# Altium schematic symbol library PowerProducts.SCHLIB: 595 symbols (part 3 of 6)
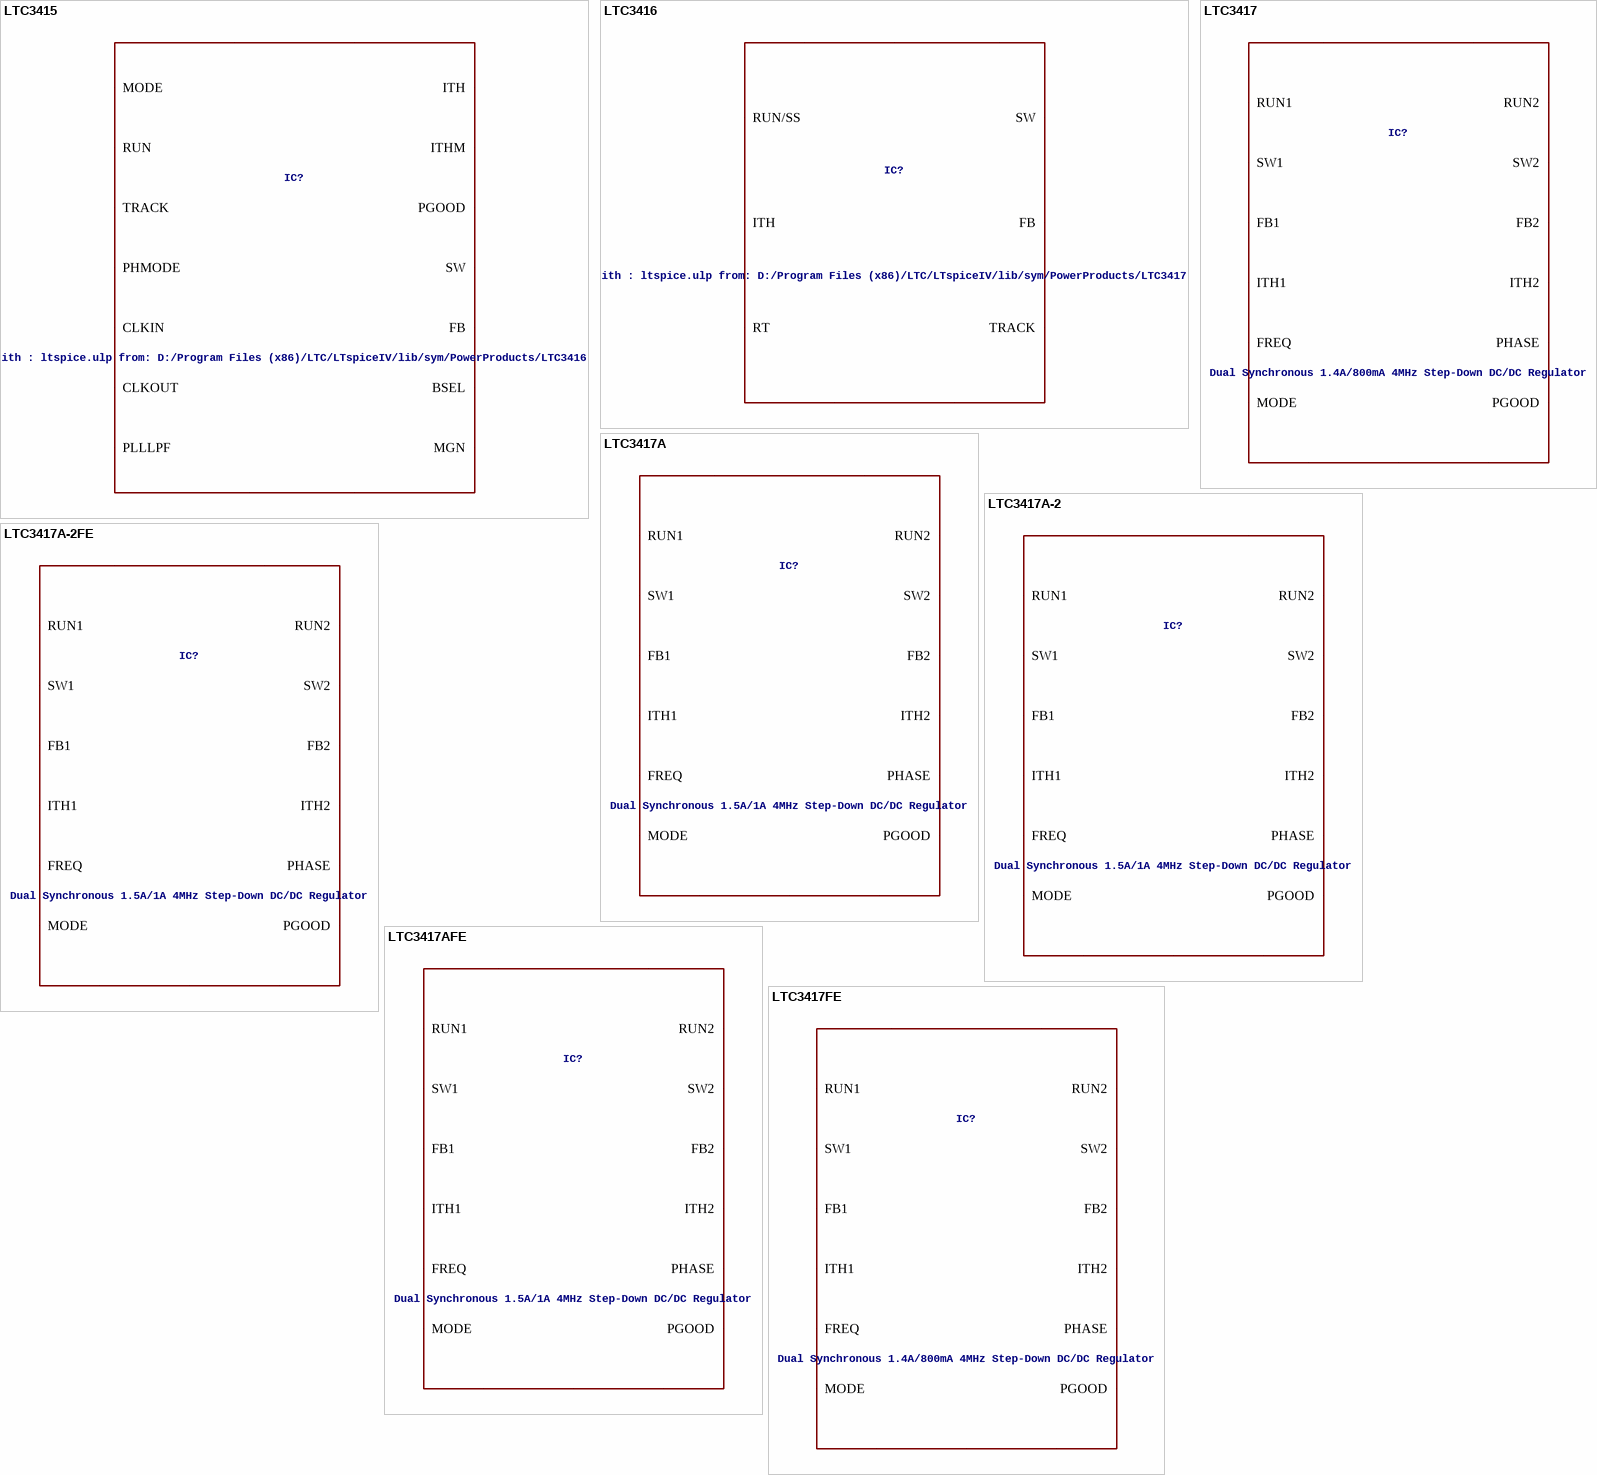
[diagram p114: symbols LTC3415 to LTC3417FE]

## LTC3417AFE
designator IC?, comment Dual Synchronous 1.5A/1A 4MHz Step-Down DC/DC Regulator
VALUE2: LTC3417A; SPICEMODEL: LTC3417A.sub; SPICEPREFIX: X
footprint TSSOP20CA(FE)
pins: 1 10 11 20 21 PGND2, 2 RUN1, 3 VIN1, 4 ITH1, 5 FB1, 6 FB2, 7 ITH2, 8 RUN2, 9 VIN2, 12 MODE, 13 SW2, 14 PGOOD, 15 FREQ, 16 GNDA, 17 PHASE, 18 SW1, 19 PGND1

## LTC3417FE
designator IC?, comment Dual Synchronous 1.4A/800mA 4MHz Step-Down DC/DC Regulator
VALUE2: LTC3417; SPICEMODEL: LTC3417.sub; SPICEPREFIX: X
footprint TSSOP20CA(FE)
pins: 1 10 11 20 21 PGND2, 2 RUN1, 3 VIN1, 4 ITH1, 5 FB1, 6 FB2, 7 ITH2, 8 RUN2, 9 VIN2, 12 MODE, 13 SW2, 14 PGOOD, 15 FREQ, 16 GNDA, 17 PHASE, 18 SW1, 19 PGND1

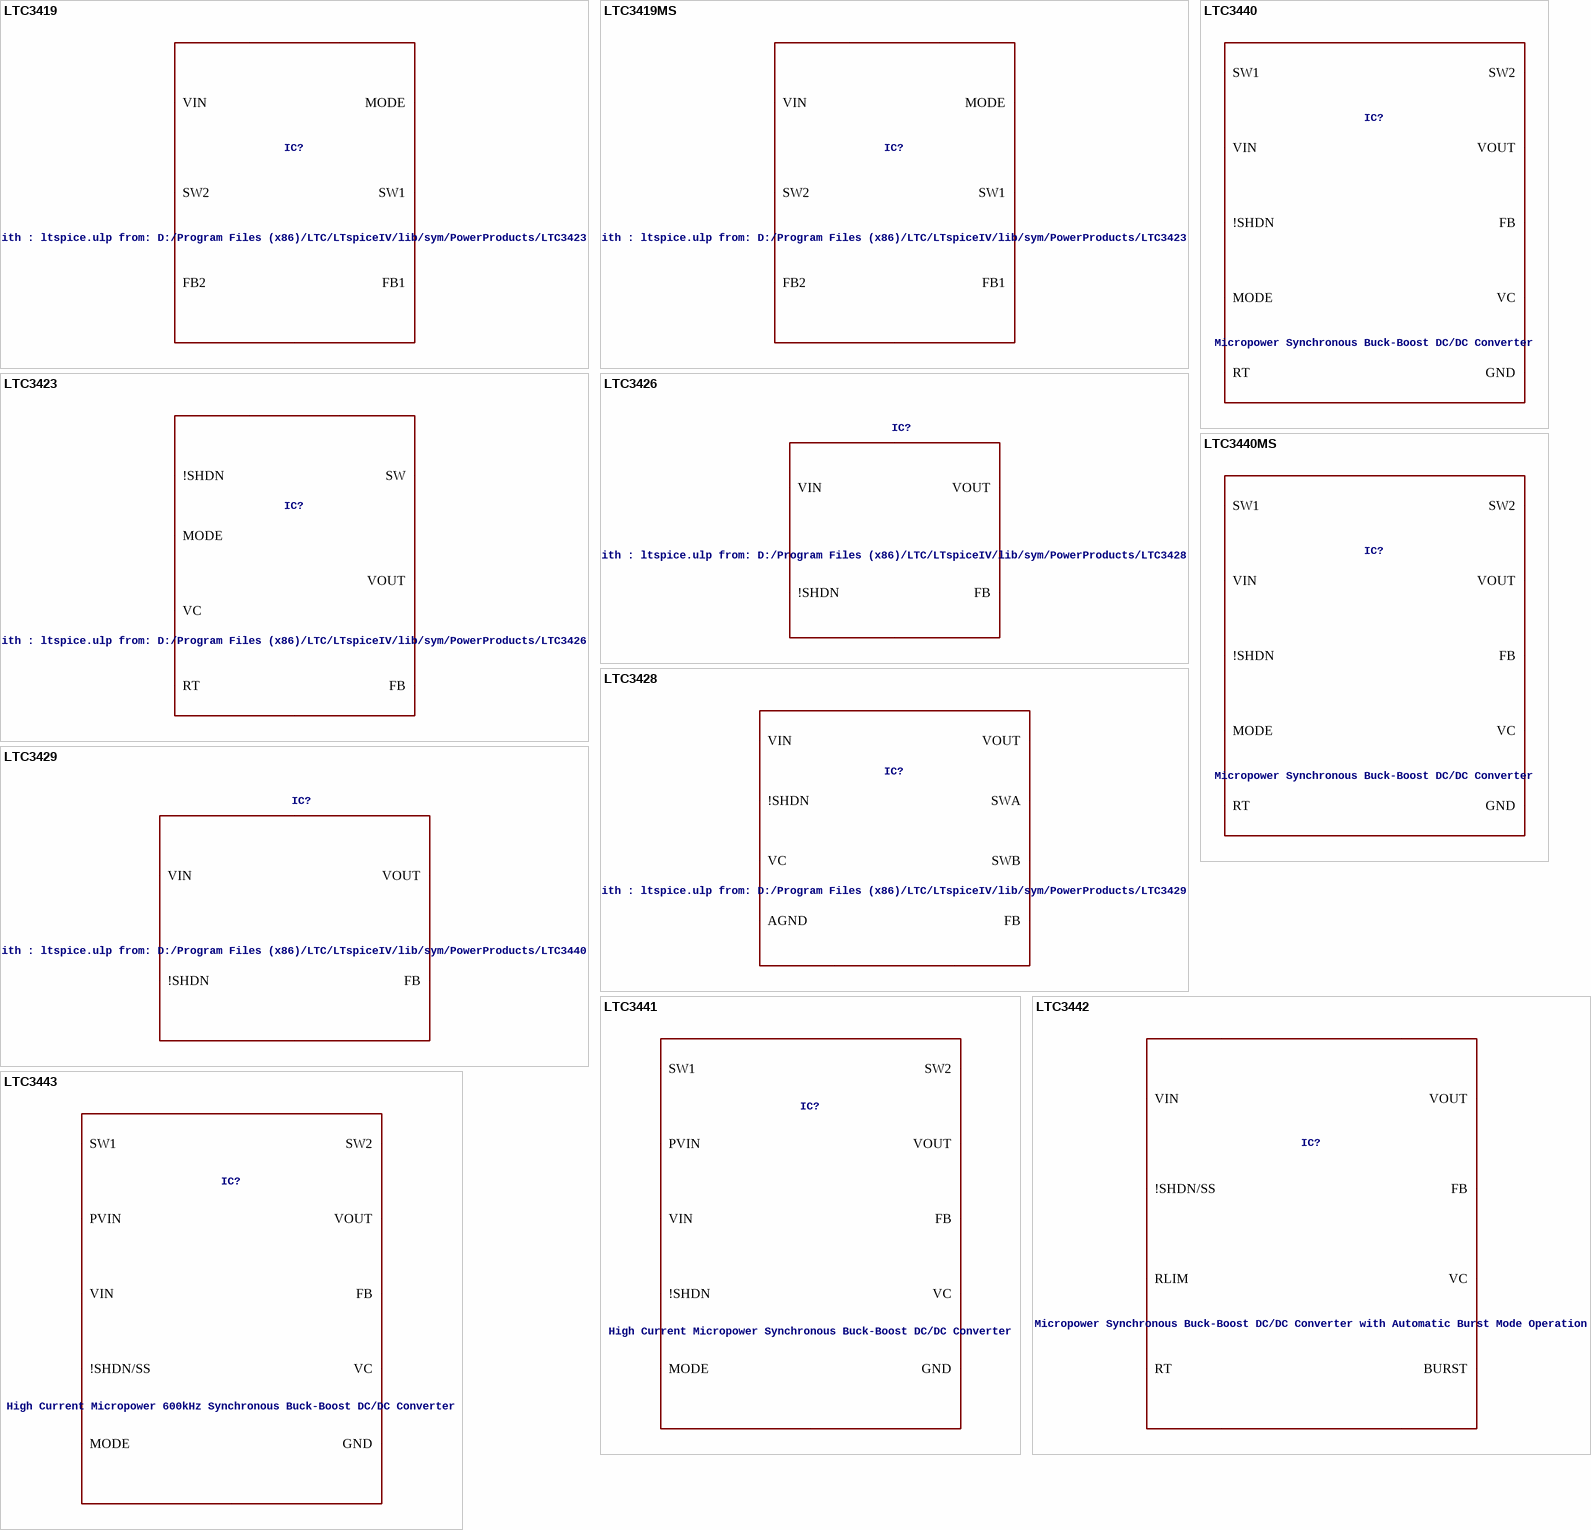
[diagram p43: symbols LTC3419 to LTC3443]

## LTC3419
designator IC?, comment LT-Spice library generated with : ltspice.ulp from: D:/Program Files (x86)/LTC/LTspiceIV/lib/sym/PowerProducts/LTC3423*.asy at 07.10.2012 18:07:52
VALUE2: LTC3419; SPICEMODEL: LTC3419.sub; SPICEPREFIX: X
footprint DFN8(DD)
pins: 1 FB1, 2 RUN1, 3 MODE, 4 SW1, 5 VIN, 6 SW2, 7 RUN2, 8 FB2, 9 GND

## LTC3419MS
designator IC?, comment LT-Spice library generated with : ltspice.ulp from: D:/Program Files (x86)/LTC/LTspiceIV/lib/sym/PowerProducts/LTC3423*.asy at 07.10.2012 18:07:52
VALUE2: LTC3419; SPICEMODEL: LTC3419.sub; SPICEPREFIX: X
footprint MSOP10(MS)
pins: 1 FB1, 2 RUN1, 3 MODE, 4 SW1, 5 6 GND, 7 VIN, 8 SW2, 9 RUN2, 10 FB2

## LTC3423
designator IC?, comment LT-Spice library generated with : ltspice.ulp from: D:/Program Files (x86)/LTC/LTspiceIV/lib/sym/PowerProducts/LTC3426*.asy at 07.10.2012 18:08:02
VALUE2: LTC3423; SPICEMODEL: LTC3423.sub; SPICEPREFIX: X
footprint MSOP10(MS)
pins: 1 RT, 2 MODE, 3 VIN, 4 SW, 5 GND, 6 VDD, 7 VOUT, 8 FB, 9 VC, 10 !SHDN

## LTC3426
designator IC?, comment LT-Spice library generated with : ltspice.ulp from: D:/Program Files (x86)/LTC/LTspiceIV/lib/sym/PowerProducts/LTC3428*.asy at 07.10.2012 18:08:11
VALUE2: LTC3426; SPICEMODEL: LTC3426.sub; SPICEPREFIX: X
footprint SOT6(S6)
pins: 1 SW, 2 GND, 3 FB, 4 !SHDN, 5 VOUT, 6 VIN

## LTC3428
designator IC?, comment LT-Spice library generated with : ltspice.ulp from: D:/Program Files (x86)/LTC/LTspiceIV/lib/sym/PowerProducts/LTC3429*.asy at 07.10.2012 18:08:16
VALUE2: LTC3428; SPICEMODEL: LTC3428.sub; SPICEPREFIX: X
footprint DFN10(DD)
pins: 1 11 PGNDA, 2 SWA, 3 VOUT, 4 !SHDN, 5 VC, 6 FB, 7 AGND, 8 VIN, 9 SWB, 10 PGNDB

## LTC3429
designator IC?, comment LT-Spice library generated with : ltspice.ulp from: D:/Program Files (x86)/LTC/LTspiceIV/lib/sym/PowerProducts/LTC3440*.asy at 07.10.2012 18:08:41
VALUE2: LTC3429; SPICEMODEL: LTC3429.sub; SPICEPREFIX: X
footprint SOT6(S6)
pins: 1 SW, 2 GND, 3 FB, 4 !SHDN, 5 VOUT, 6 VIN

## LTC3440
designator IC?, comment Micropower Synchronous Buck-Boost DC/DC Converter
VALUE2: LTC3440; SPICEMODEL: LTC3440.sub; SPICEPREFIX: X
footprint DFN10(DD)
pins: 1 RT, 2 MODE, 3 SW1, 4 SW2, 5 11 GND, 6 VOUT, 7 VIN, 8 !SHDN, 9 FB, 10 VC

## LTC3440MS
designator IC?, comment Micropower Synchronous Buck-Boost DC/DC Converter
VALUE2: LTC3440; SPICEMODEL: LTC3440.sub; SPICEPREFIX: X
footprint MSOP10(MS)
pins: 1 RT, 2 MODE, 3 SW1, 4 SW2, 5 GND, 6 VOUT, 7 VIN, 8 !SHDN, 9 FB, 10 VC

## LTC3441
designator IC?, comment High Current Micropower Synchronous Buck-Boost DC/DC Converter
VALUE2: LTC3441; SPICEMODEL: LTC3441.sub; SPICEPREFIX: X
footprint DFN12(DE)
pins: 1 !SHDN, 2 GND, 3 6 13 PGND, 4 SW1, 5 SW2, 7 MODE, 8 VOUT, 9 PVIN, 10 VIN, 11 VC, 12 FB

## LTC3442
designator IC?, comment Micropower Synchronous Buck-Boost DC/DC Converter with Automatic Burst Mode Operation
VALUE2: LTC3442; SPICEMODEL: LTC3442.sub; SPICEPREFIX: X
footprint DFN12(DE)
pins: 1 !SHDN/SS, 2 RT, 3 SGND, 4 SW1, 5 13 PGND, 6 SW2, 7 BURST, 8 VOUT, 9 VIN, 10 RLIM, 11 VC, 12 FB

## LTC3443
designator IC?, comment High Current Micropower 600kHz Synchronous Buck-Boost DC/DC Converter
VALUE2: LTC3443; SPICEMODEL: LTC3443.sub; SPICEPREFIX: X
footprint DFN12(DE)
pins: 1 !SHDN/SS, 2 GND, 3 6 13 PGND, 4 SW1, 5 SW2, 7 MODE, 8 VOUT, 9 PVIN, 10 VIN, 11 VC, 12 FB

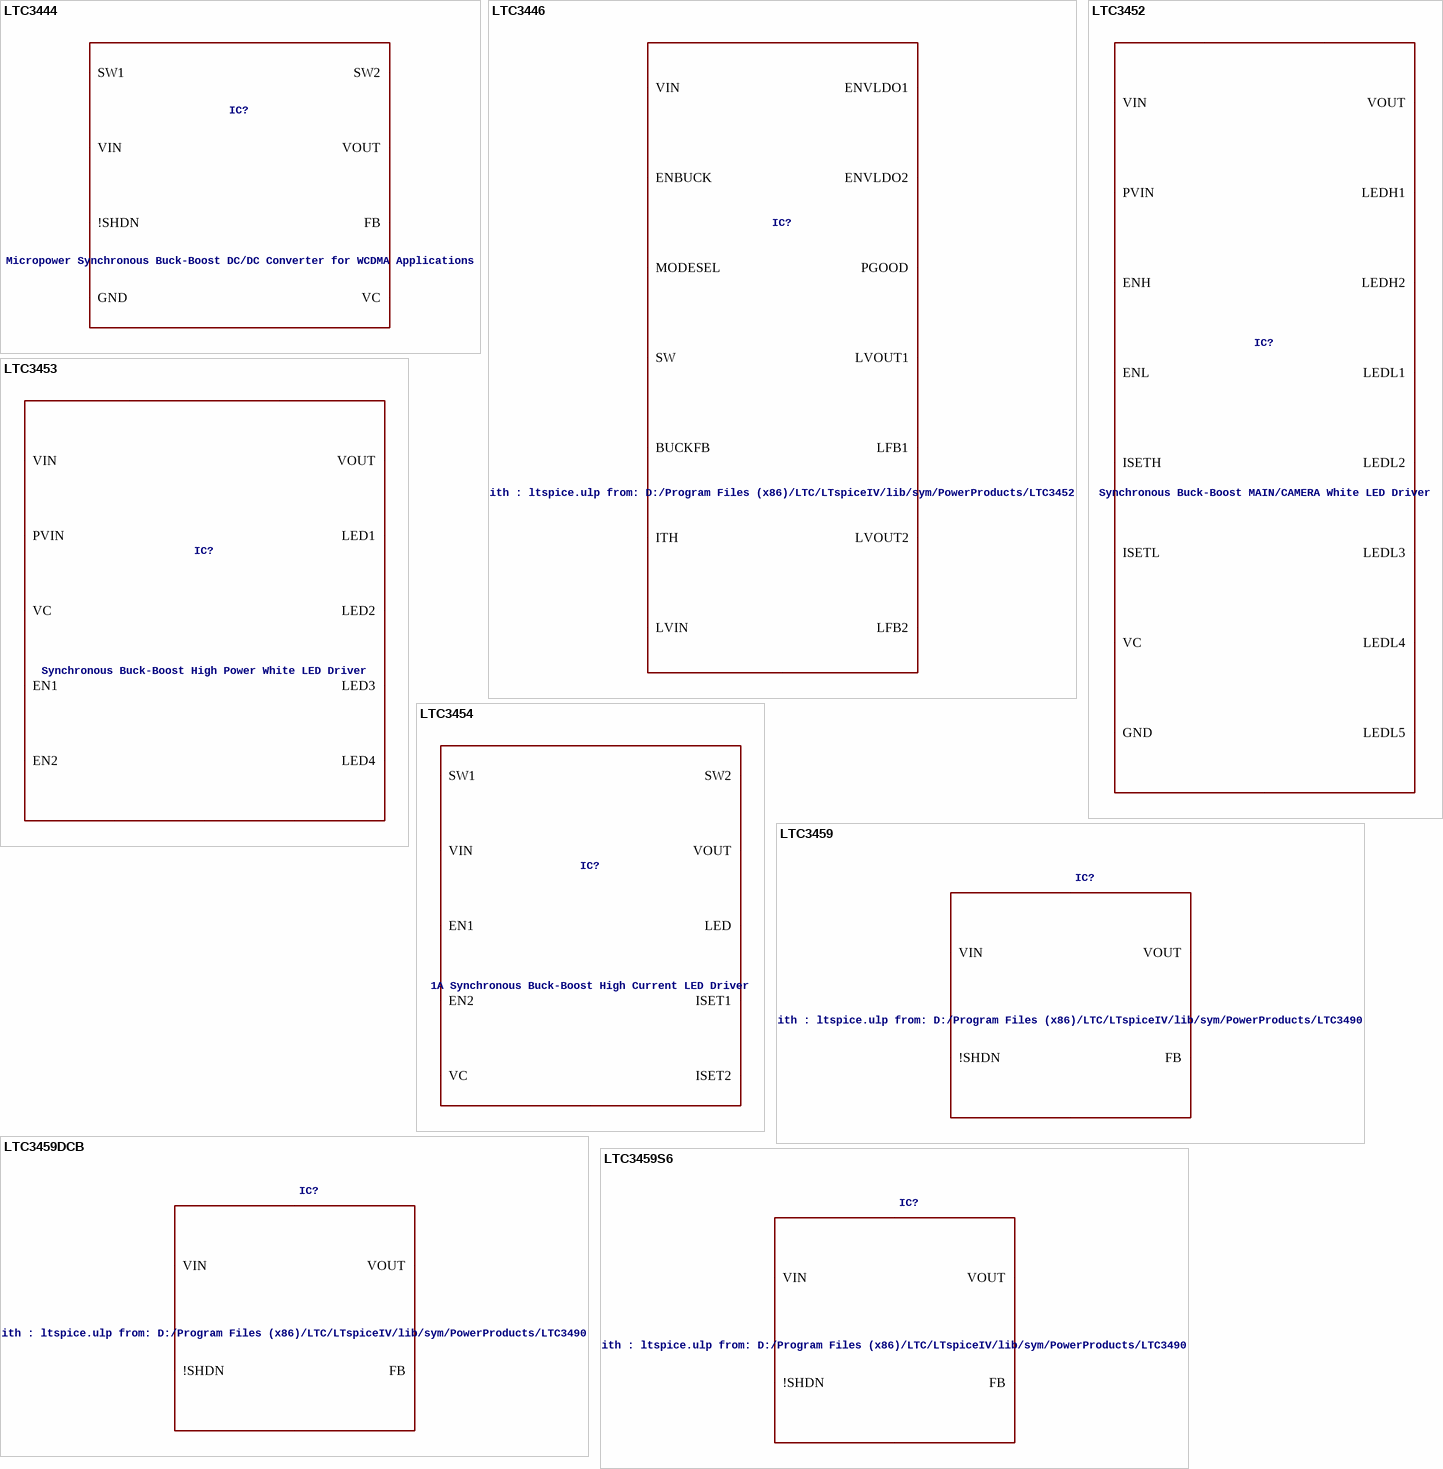
[diagram p44: symbols LTC3444 to LTC3459S6]

## LTC3444
designator IC?, comment Micropower Synchronous Buck-Boost DC/DC Converter for WCDMA Applications
VALUE2: LTC3444; SPICEMODEL: LTC3444.sub; SPICEPREFIX: X
footprint DFN8(DD)
pins: 1 !SHDN, 2 SW1, 3 9 GND, 4 SW2, 5 VOUT, 6 VIN, 7 VC, 8 FB

## LTC3446
designator IC?, comment LT-Spice library generated with : ltspice.ulp from: D:/Program Files (x86)/LTC/LTspiceIV/lib/sym/PowerProducts/LTC3452*.asy at 07.10.2012 18:09:42
VALUE2: LTC3446; SPICEMODEL: LTC3446.sub; SPICEPREFIX: X
footprint DFN14(DE)
pins: 1 MODESEL, 2 VIN, 3 ITH, 4 PGOOD, 5 LVOUT1, 6 LVIN, 7 LVOUT2, 8 ENVLDO2, 9 LFB2, 10 LFB1, 11 ENVLDO1, 12 BUCKFB, 13 ENBUCK, 14 SW, 15 GND

## LTC3452
designator IC?, comment Synchronous Buck-Boost MAIN/CAMERA White LED Driver
VALUE2: LTC3452; SPICEMODEL: LTC3452.sub; SPICEPREFIX: X
footprint QFN20(UF)
pins: 1 VIN, 2 ENL, 3 ISETL, 4 LEDL1, 5 LEDL2, 6 LEDL3, 7 LEDL4, 8 LEDL5, 9 11 21 GND, 10 LEDH1, 12 LEDH2, 13 ISETH, 14 ENH, 15 VC, 16 VOUT, 17 SW2, 18 PGND, 19 SW1, 20 PVIN

## LTC3453
designator IC?, comment Synchronous Buck-Boost High Power White LED Driver
VALUE2: LTC3453; SPICEMODEL: LTC3453.sub; SPICEPREFIX: X
footprint QFN16(UF)
pins: 1 VIN, 2 EN1, 3 ISET1, 4 LED1, 5 8 17 GND, 6 LED2, 7 LED3, 9 LED4, 10 ISET2, 11 EN2, 12 VC, 13 VOUT, 14 SW2, 15 SW1, 16 PVIN

## LTC3454
designator IC?, comment 1A Synchronous Buck-Boost High Current LED Driver
VALUE2: LTC3454; SPICEMODEL: LTC3454.sub; SPICEPREFIX: X
footprint DFN10(DD)
pins: 1 EN1, 2 EN2, 3 ISET1, 4 ISET2, 5 LED, 6 SW2, 7 VOUT, 8 VC, 9 VIN, 10 SW1, 11 GND

## LTC3459
designator IC?, comment LT-Spice library generated with : ltspice.ulp from: D:/Program Files (x86)/LTC/LTspiceIV/lib/sym/PowerProducts/LTC3490*.asy at 07.10.2012 18:10:42
VALUE2: LTC3459; SPICEMODEL: LTC3459.sub; SPICEPREFIX: X
footprint DFN6(DC)
pins: 1 VIN, 2 VOUT, 3 !SHDN, 4 FB, 5 7 GND, 6 SW

## LTC3459DCB
designator IC?, comment LT-Spice library generated with : ltspice.ulp from: D:/Program Files (x86)/LTC/LTspiceIV/lib/sym/PowerProducts/LTC3490*.asy at 07.10.2012 18:10:42
VALUE2: LTC3459; SPICEMODEL: LTC3459.sub; SPICEPREFIX: X
footprint DFN6(DCB)
pins: 1 !SHDN, 2 VOUT, 3 FB, 4 SW, 5 7 GND, 6 VIN

## LTC3459S6
designator IC?, comment LT-Spice library generated with : ltspice.ulp from: D:/Program Files (x86)/LTC/LTspiceIV/lib/sym/PowerProducts/LTC3490*.asy at 07.10.2012 18:10:42
VALUE2: LTC3459; SPICEMODEL: LTC3459.sub; SPICEPREFIX: X
footprint SOT6(S6)
pins: 1 SW, 2 GND, 3 FB, 4 !SHDN, 5 VOUT, 6 VIN

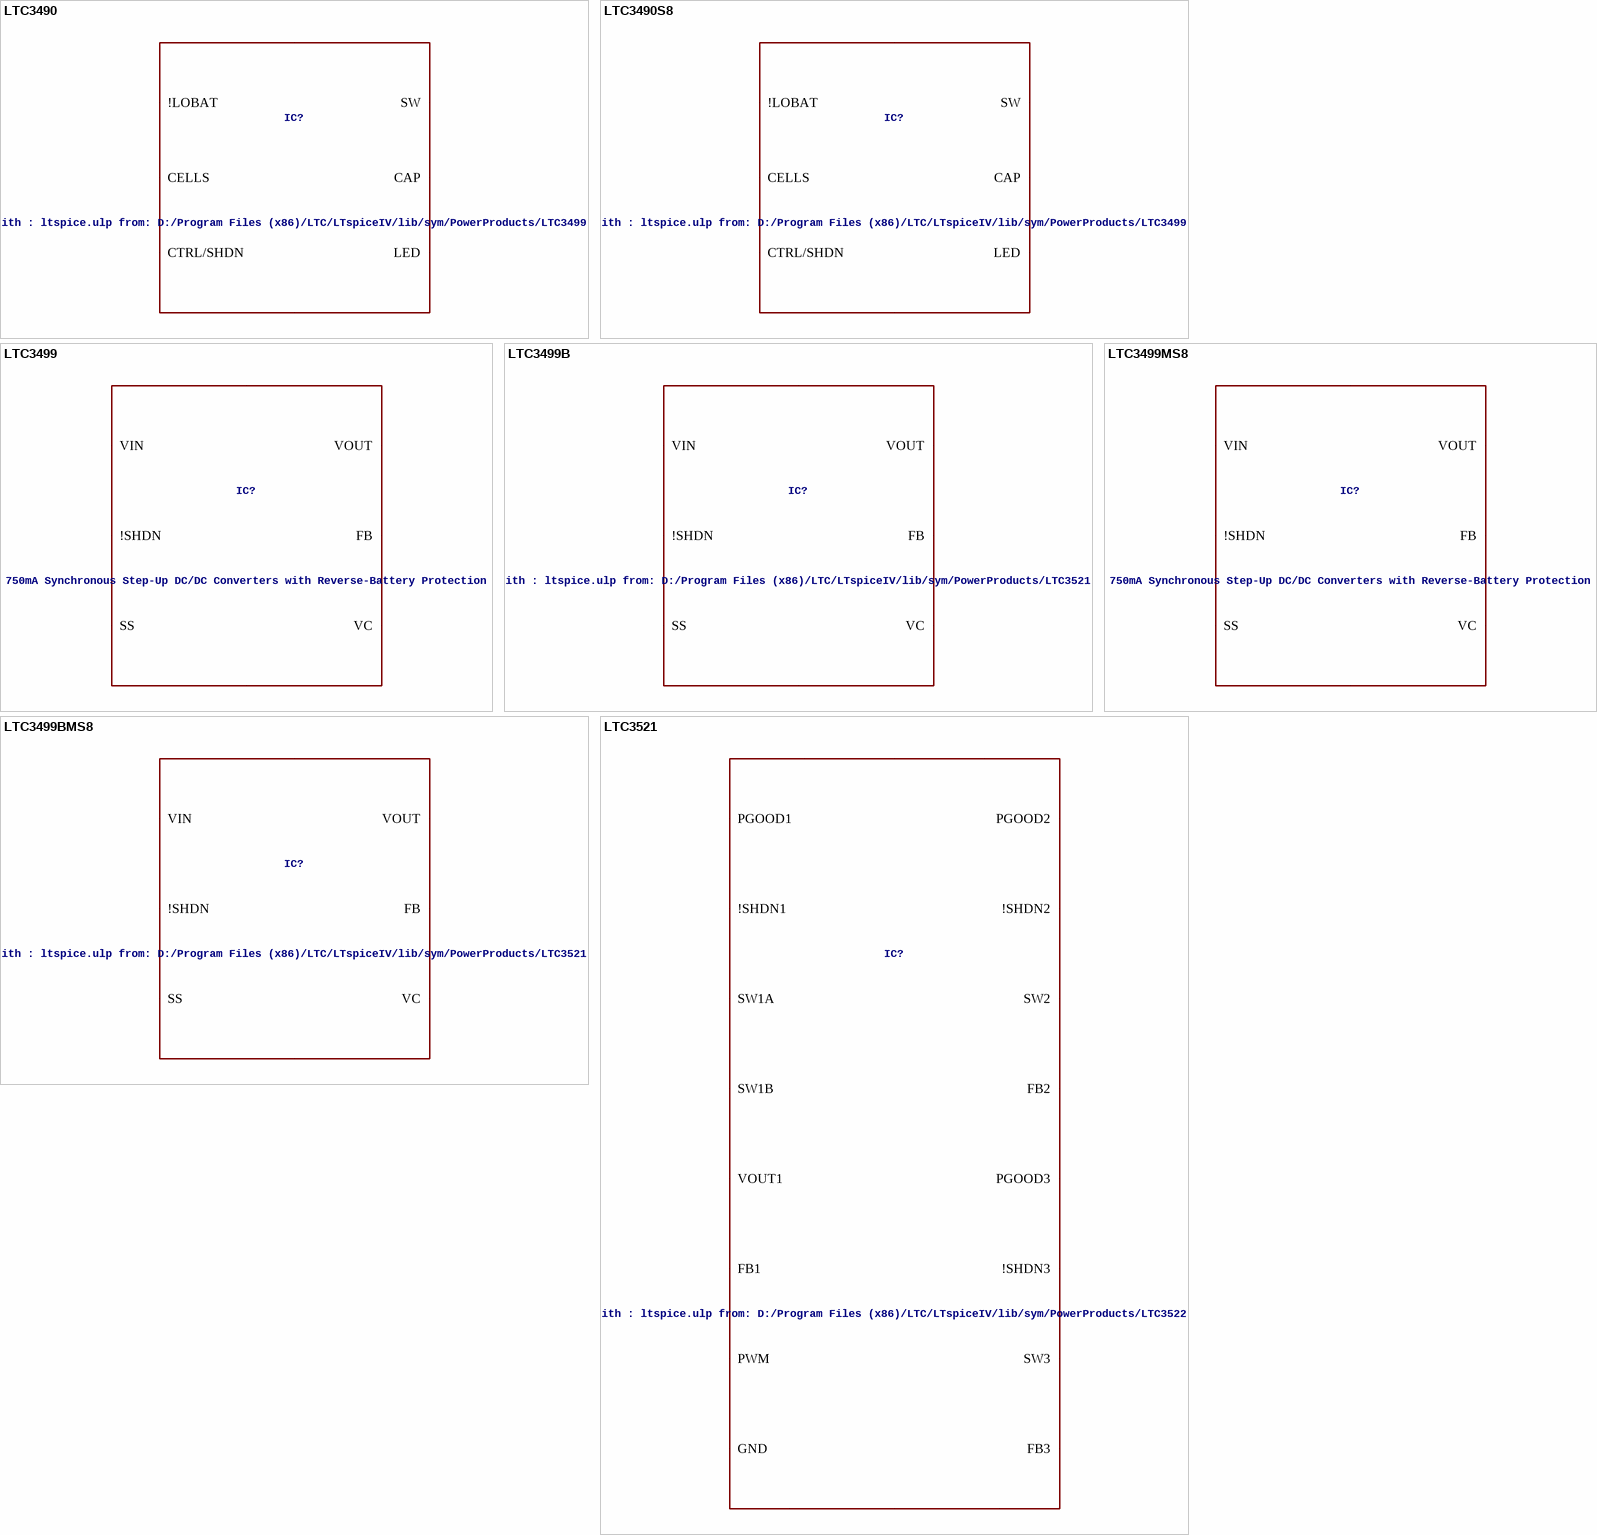
[diagram p45: symbols LTC3490 to LTC3521]

## LTC3490
designator IC?, comment LT-Spice library generated with : ltspice.ulp from: D:/Program Files (x86)/LTC/LTspiceIV/lib/sym/PowerProducts/LTC3499*.asy at 07.10.2012 18:10:54
VALUE2: LTC3490; SPICEMODEL: LTC3490.sub; SPICEPREFIX: X
footprint DFN8(DD)
pins: 1 CELLS, 2 VIN, 3 SW, 4 9 GND, 5 LED, 6 CAP, 7 !LOBAT, 8 CTRL/SHDN

## LTC3490S8
designator IC?, comment LT-Spice library generated with : ltspice.ulp from: D:/Program Files (x86)/LTC/LTspiceIV/lib/sym/PowerProducts/LTC3499*.asy at 07.10.2012 18:10:54
VALUE2: LTC3490; SPICEMODEL: LTC3490.sub; SPICEPREFIX: X
footprint SO8(S8)
pins: 1 CELLS, 2 VIN, 3 SW, 4 GND, 5 LED, 6 CAP, 7 !LOBAT, 8 CTRL/SHDN

## LTC3499
designator IC?, comment 750mA Synchronous Step-Up DC/DC Converters with Reverse-Battery Protection
VALUE2: LTC3499; SPICEMODEL: LTC3499.sub; SPICEPREFIX: X
footprint DFN8(DD)
pins: 1 !SHDN, 2 VIN, 3 SW, 4 9 GND, 5 SS, 6 VOUT, 7 FB, 8 VC

## LTC3499B
designator IC?, comment LT-Spice library generated with : ltspice.ulp from: D:/Program Files (x86)/LTC/LTspiceIV/lib/sym/PowerProducts/LTC3521*.asy at 07.10.2012 18:11:28
VALUE2: LTC3499B; SPICEMODEL: LTC3499B.sub; SPICEPREFIX: X
footprint DFN8(DD)
pins: 1 !SHDN, 2 VIN, 3 SW, 4 9 GND, 5 SS, 6 VOUT, 7 FB, 8 VC

## LTC3499BMS8
designator IC?, comment LT-Spice library generated with : ltspice.ulp from: D:/Program Files (x86)/LTC/LTspiceIV/lib/sym/PowerProducts/LTC3521*.asy at 07.10.2012 18:11:28
VALUE2: LTC3499B; SPICEMODEL: LTC3499B.sub; SPICEPREFIX: X
footprint MSOP8(MS8)
pins: 1 !SHDN, 2 VIN, 3 SW, 4 GND, 5 SS, 6 VOUT, 7 FB, 8 VC

## LTC3499MS8
designator IC?, comment 750mA Synchronous Step-Up DC/DC Converters with Reverse-Battery Protection
VALUE2: LTC3499; SPICEMODEL: LTC3499.sub; SPICEPREFIX: X
footprint MSOP8(MS8)
pins: 1 !SHDN, 2 VIN, 3 SW, 4 GND, 5 SS, 6 VOUT, 7 FB, 8 VC

## LTC3521
designator IC?, comment LT-Spice library generated with : ltspice.ulp from: D:/Program Files (x86)/LTC/LTspiceIV/lib/sym/PowerProducts/LTC3522*.asy at 07.10.2012 18:11:34
VALUE2: LTC3521; SPICEMODEL: LTC3521.sub; SPICEPREFIX: X
footprint QFN24(UF)
pins: 1 !SHDN2, 2 PGOOD3, 3 PGOOD2, 4 PGOOD1, 5 VIN, 6 GND, 7 PWM, 8 FB1, 9 !SHDN3, 10 !SHDN1, 11 PVIN1, 12 PGND1B, 14 SW1B, 15 SW1A, 16 VOUT1, 17 SW3, 18 PGND2, 20 SW2, 21 25 PGND1A, 22 PVIN2, 23 FB3, 24 FB2

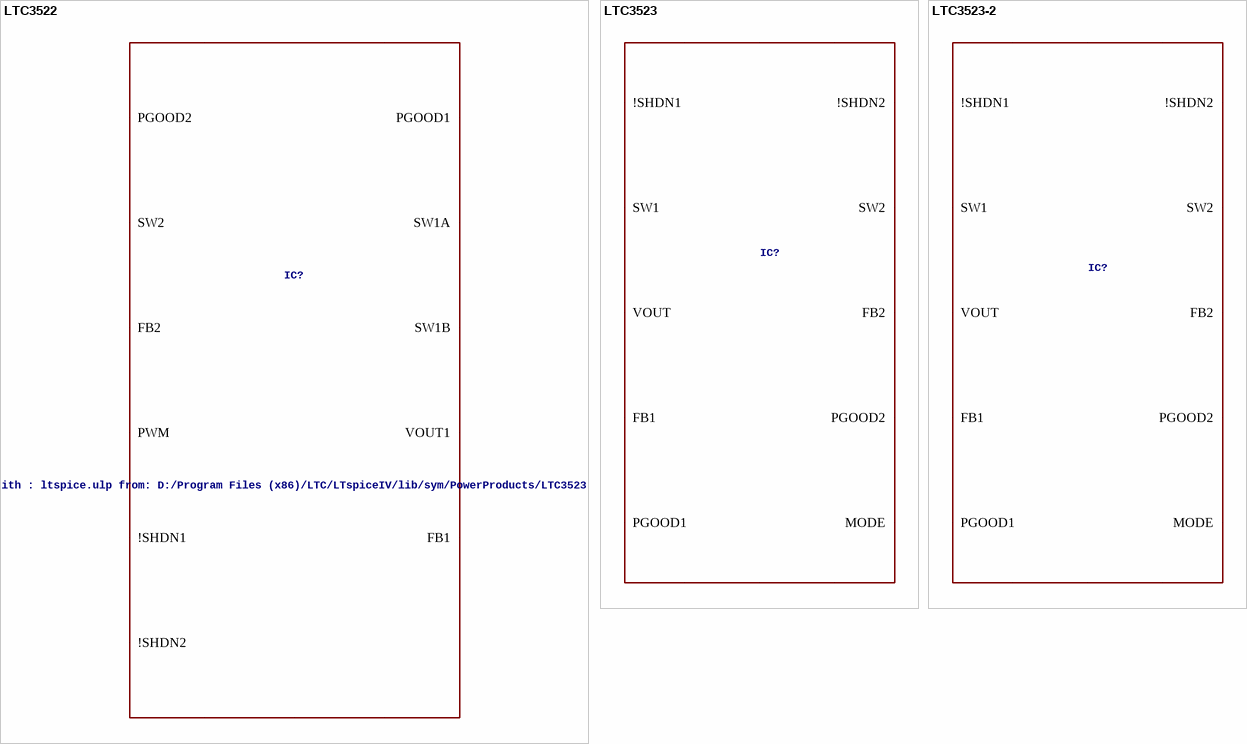
[diagram p46: symbols LTC3522 to LTC3523-2]

## LTC3522
designator IC?, comment LT-Spice library generated with : ltspice.ulp from: D:/Program Files (x86)/LTC/LTspiceIV/lib/sym/PowerProducts/LTC3523*.asy at 07.10.2012 18:11:40
VALUE2: LTC3522; SPICEMODEL: LTC3522.sub; SPICEPREFIX: X
footprint QFN16(UD)
pins: 1 FB2, 2 PWM, 3 17 GND, 4 PGOOD2, 5 FB1, 6 PGOOD1, 7 !SHDN1, 8 PVIN1, 9 PGND2, 10 SW1B, 11 SW1A, 12 VOUT1, 13 PGND1, 14 SW2, 15 PVIN2, 16 !SHDN2

## LTC3523
designator IC?, comment LT-Spice library generated with : ltspice.ulp from: D:/Program Files (x86)/LTC/LTspiceIV/lib/sym/PowerProducts/LTC3523-2*.asy at 07.10.2012 18:11:48  (value not drawn)
SPICEMODEL: LTC3523.sub; SPICEPREFIX: X; VALUE2: LTC3523
footprint QFN16(UD)
pins: 1 FB1, 2 VIN1, 3 PGOOD1, 4 VOUT, 5 SW1, 6 GND1, 7 GND2, 8 SW2, 9 VIN2, 10 MODE, 11 PGOOD2, 12 FB2, 13 !SHDN2, 14 17 GND3, 15 VBAT, 16 !SHDN1

## LTC3523-2
designator IC?, comment LT-Spice library generated with : ltspice.ulp from: D:/Program Files (x86)/LTC/LTspiceIV/lib/sym/PowerProducts/LTC3524*.asy at 07.10.2012 18:12:25  (value not drawn)
VALUE2: LTC3523-2; SPICEMODEL: LTC3523-2.sub; SPICEPREFIX: X
footprint QFN16(UD)
pins: 1 FB1, 2 VIN1, 3 PGOOD1, 4 VOUT, 5 SW1, 6 GND1, 7 GND2, 8 SW2, 9 VIN2, 10 MODE, 11 PGOOD2, 12 FB2, 13 !SHDN2, 14 17 GND3, 15 VBAT, 16 !SHDN1

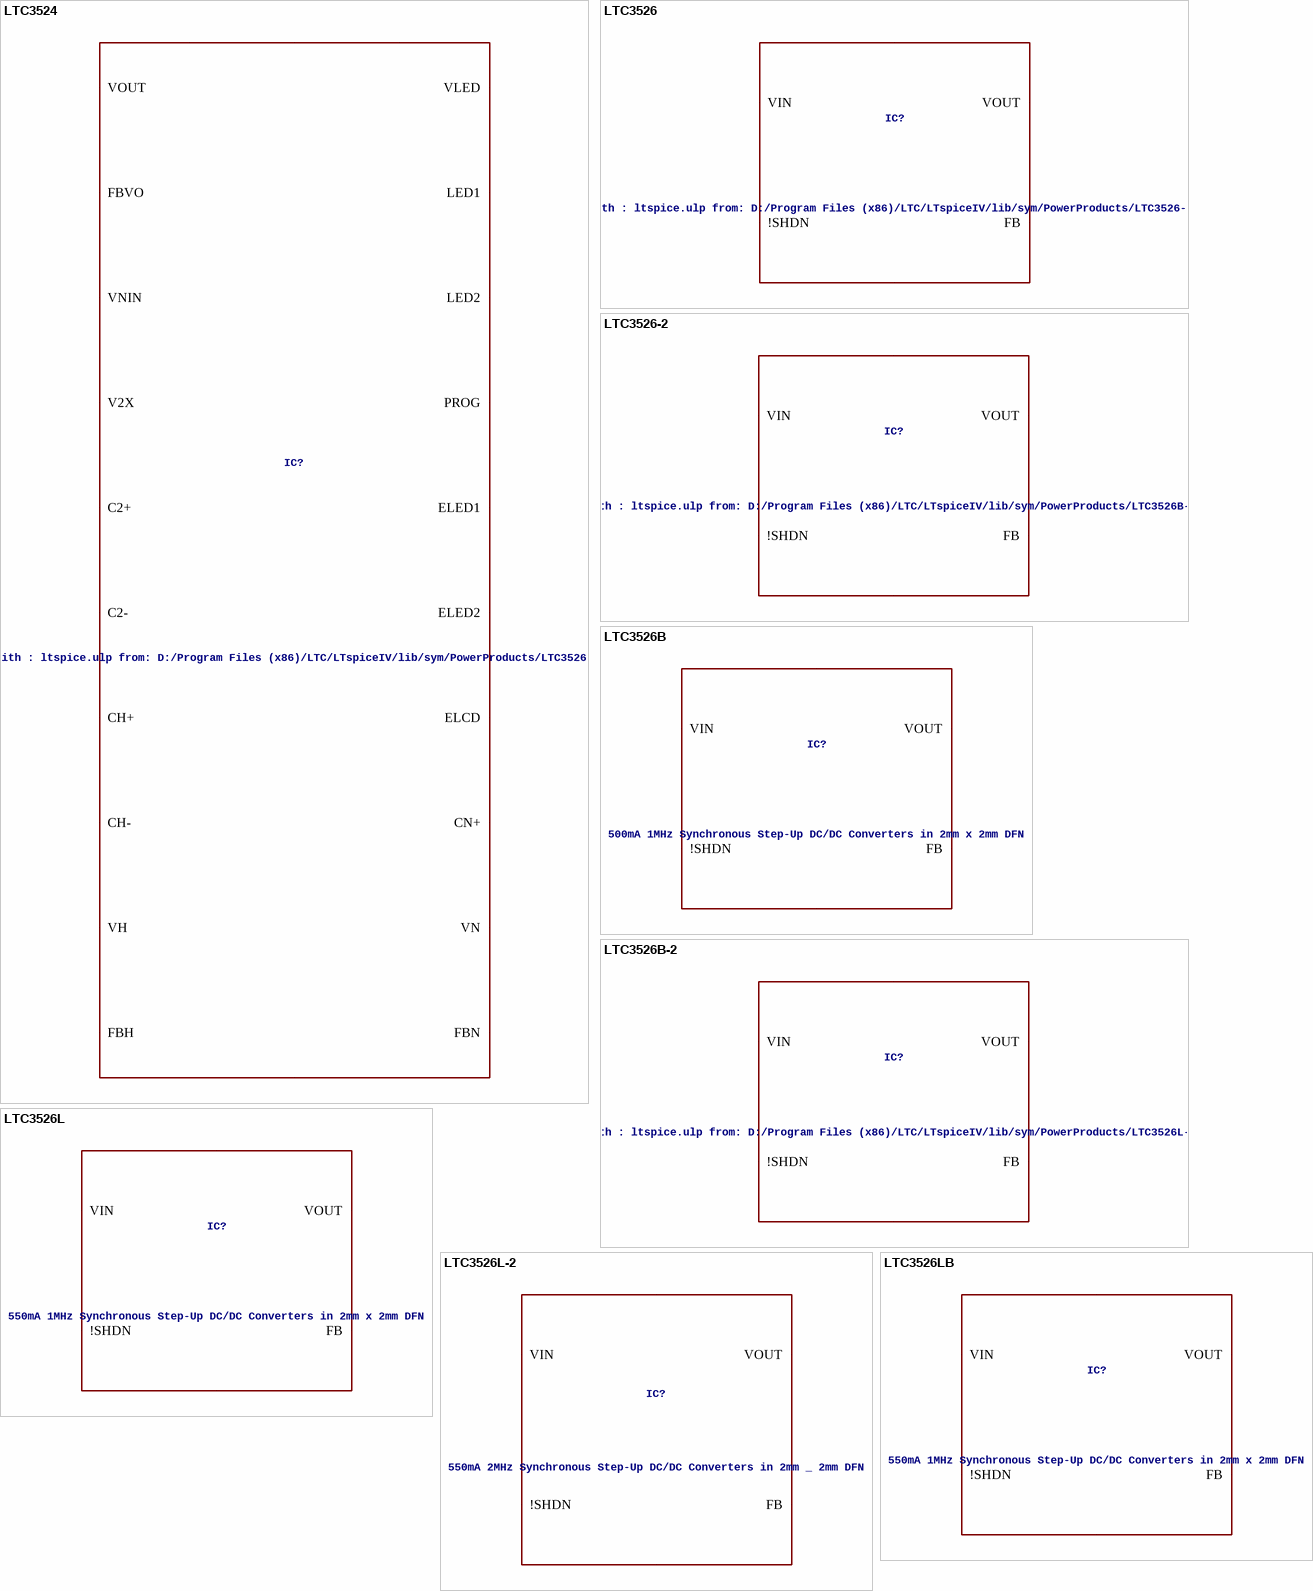
[diagram p47: symbols LTC3524 to LTC3526LB]

## LTC3524
designator IC?, comment LT-Spice library generated with : ltspice.ulp from: D:/Program Files (x86)/LTC/LTspiceIV/lib/sym/PowerProducts/LTC3526*.asy at 07.10.2012 18:13:39
VALUE2: LTC3524; SPICEMODEL: LTC3524.sub; SPICEPREFIX: X
footprint QFN24(UF)
pins: 1 ELCD, 2 VIN, 3 FBVO, 4 VOUT, 5 SW1, 6 C2-, 7 C2+, 8 V2X, 9 VNIN, 10 CN+, 12 VN, 13 FBN, 14 FBH, 15 VH, 16 CH+, 17 CH-, 18 LED2, 19 LED1, 20 VLED, 21 SW2, 22 ELED2, 23 PROG, 24 ELED1, 25 GND

## LTC3526
designator IC?, comment LT-Spice library generated with : ltspice.ulp from: D:/Program Files (x86)/LTC/LTspiceIV/lib/sym/PowerProducts/LTC3526-2*.asy at 07.10.2012 18:13:48
SPICEMODEL: LTC3526.sub; SPICEPREFIX: X; VALUE2: LTC3526
footprint DFN6(DC)
pins: 1 SW, 2 7 GND, 3 VIN, 4 !SHDN, 5 FB, 6 VOUT

## LTC3526-2
designator IC?, comment LT-Spice library generated with : ltspice.ulp from: D:/Program Files (x86)/LTC/LTspiceIV/lib/sym/PowerProducts/LTC3526B-2*.asy at 07.10.2012 18:14:01
VALUE2: LTC3526-2; SPICEMODEL: LTC3526-2.sub; SPICEPREFIX: X
footprint DFN6(DC)
pins: 1 SW, 2 7 GND, 3 VIN, 4 !SHDN, 5 FB, 6 VOUT

## LTC3526B
designator IC?, comment 500mA 1MHz Synchronous Step-Up DC/DC Converters in 2mm x 2mm DFN
VALUE2: LTC3526B; SPICEMODEL: LTC3526B.sub; SPICEPREFIX: X
footprint DFN6(DC)
pins: 1 SW, 2 7 GND, 3 VIN, 4 !SHDN, 5 FB, 6 VOUT

## LTC3526B-2
designator IC?, comment LT-Spice library generated with : ltspice.ulp from: D:/Program Files (x86)/LTC/LTspiceIV/lib/sym/PowerProducts/LTC3526L-2*.asy at 07.10.2012 18:14:23
VALUE2: LTC3526B-2; SPICEMODEL: LTC3526B-2.sub; SPICEPREFIX: X
footprint DFN6(DC)
pins: 1 SW, 2 7 GND, 3 VIN, 4 !SHDN, 5 FB, 6 VOUT

## LTC3526L
designator IC?, comment 550mA 1MHz Synchronous Step-Up DC/DC Converters in 2mm x 2mm DFN
VALUE2: LTC3526L; SPICEMODEL: LTC3526L.sub; SPICEPREFIX: X
footprint DFN6(DC)
pins: 1 SW, 2 7 GND, 3 VIN, 4 !SHDN, 5 FB, 6 VOUT

## LTC3526L-2
designator IC?, comment 550mA 2MHz Synchronous Step-Up DC/DC Converters in 2mm _ 2mm DFN
VALUE2: LTC3526L-2; SPICEMODEL: LTC3526L-2.sub; SPICEPREFIX: X
footprint DFN6(DC)
pins: 1 SW, 2 7 GND, 3 VIN, 4 !SHDN, 5 FB, 6 VOUT

## LTC3526LB
designator IC?, comment 550mA 1MHz Synchronous Step-Up DC/DC Converters in 2mm x 2mm DFN
VALUE2: LTC3526LB; SPICEMODEL: LTC3526LB.sub; SPICEPREFIX: X
footprint DFN6(DC)
pins: 1 SW, 2 7 GND, 3 VIN, 4 !SHDN, 5 FB, 6 VOUT

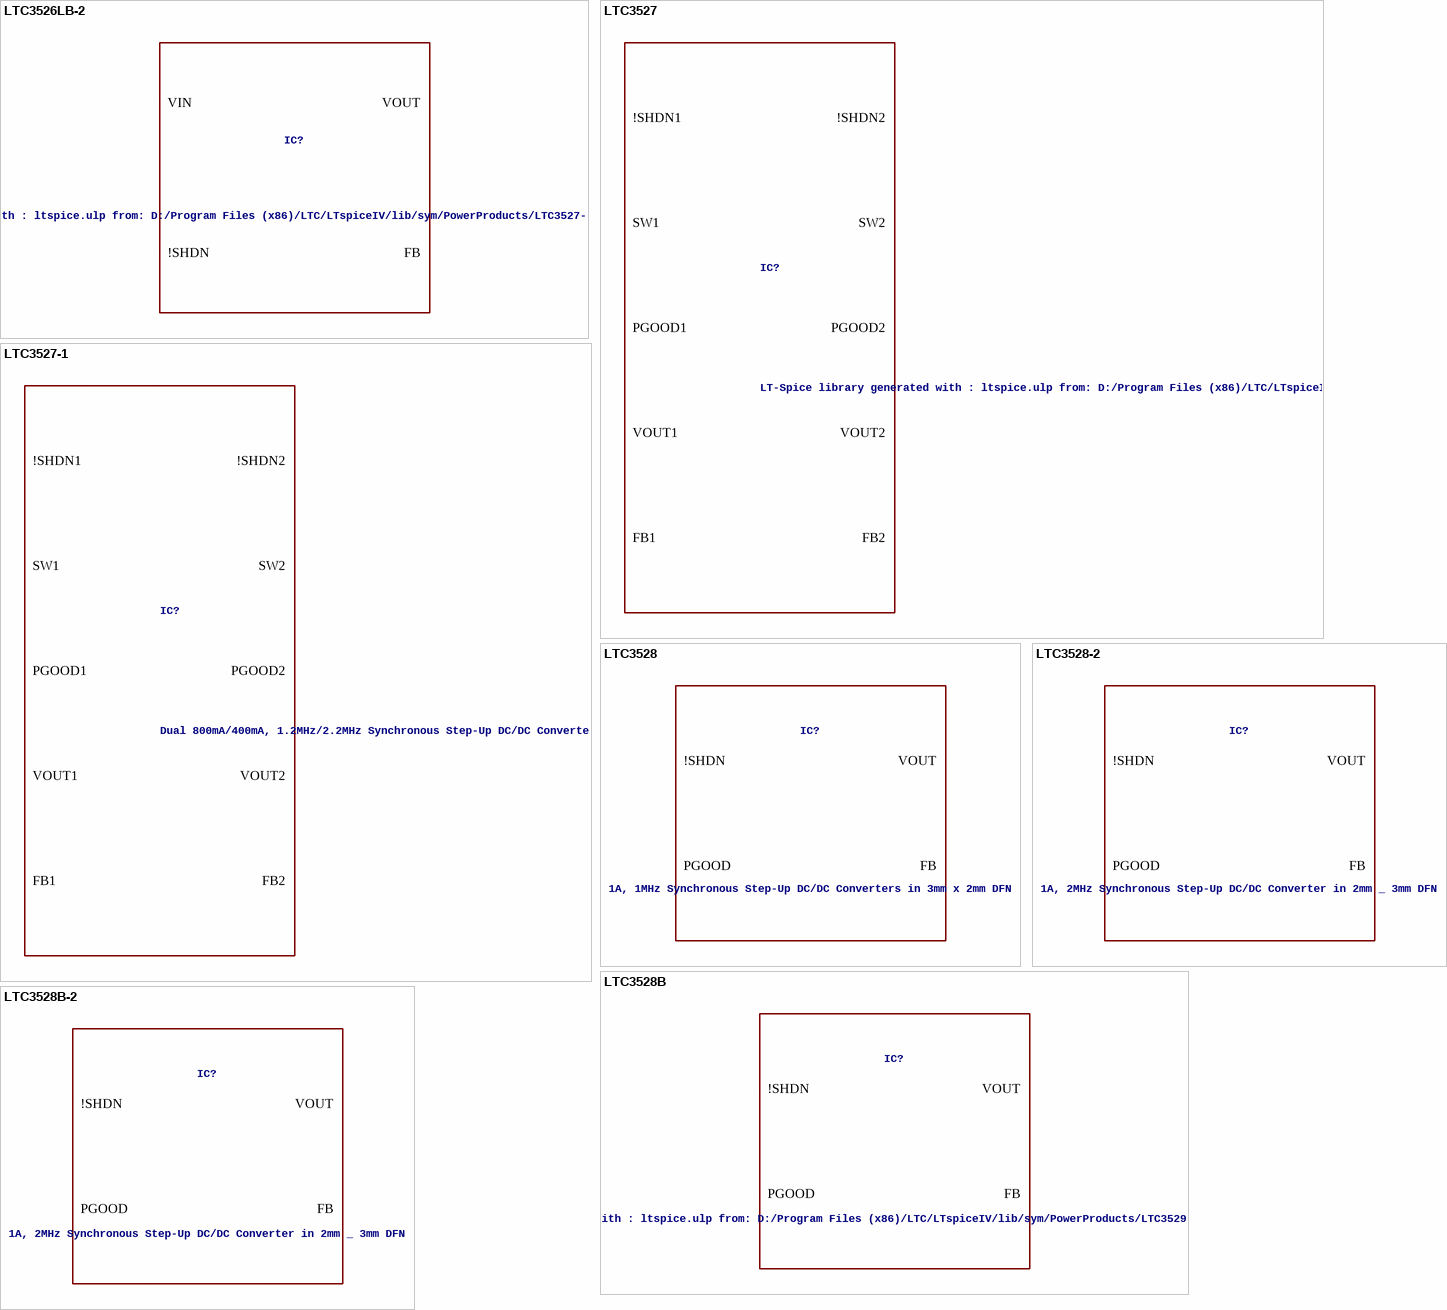
[diagram p48: symbols LTC3526LB-2 to LTC3528B-2]

## LTC3526LB-2
designator IC?, comment LT-Spice library generated with : ltspice.ulp from: D:/Program Files (x86)/LTC/LTspiceIV/lib/sym/PowerProducts/LTC3527-1*.asy at 07.10.2012 18:14:45
VALUE2: LTC3526LB-2; SPICEMODEL: LTC3526LB-2.sub; SPICEPREFIX: X
footprint DFN6(DC)
pins: 1 SW, 2 7 GND, 3 VIN, 4 !SHDN, 5 FB, 6 VOUT

## LTC3527
designator IC?, comment LT-Spice library generated with : ltspice.ulp from: D:/Program Files (x86)/LTC/LTspiceIV/lib/sym/PowerProducts/LTC3528-2*.asy at 07.10.2012 18:14:56
VALUE2: LTC3527; SPICEMODEL: LTC3527.sub; SPICEPREFIX: X
footprint QFN16(UD)
pins: 1 !SHDN1, 2 FB1, 3 MODE, 4 VIN1, 5 VOUT1, 6 SW1, 7 SW2, 8 VOUT2, 9 VIN2, 10 FSEL, 11 FB2, 12 !SHDN2, 13 PGOOD2, 14 17 GND, 15 VIN, 16 PGOOD1

## LTC3527-1
designator IC?, comment Dual 800mA/400mA, 1.2MHz/2.2MHz Synchronous Step-Up DC/DC Converters
VALUE2: LTC3527-1; SPICEMODEL: LTC3527-1.sub; SPICEPREFIX: X
footprint QFN16(UD)
pins: 1 !SHDN1, 2 FB1, 3 MODE, 4 VIN1, 5 VOUT1, 6 SW1, 7 SW2, 8 VOUT2, 9 VIN2, 10 FSEL, 11 FB2, 12 !SHDN2, 13 PGOOD2, 14 17 GND, 15 VIN, 16 PGOOD1

## LTC3528
designator IC?, comment 1A, 1MHz Synchronous Step-Up DC/DC Converters in 3mm x 2mm DFN
VALUE2: LTC3528; SPICEMODEL: LTC3528.sub; SPICEPREFIX: X
footprint DFN8(DDB)
pins: 1 !SHDN, 2 FB, 3 PGOOD, 4 VOUT, 5 SW, 6 PGND, 7 9 SGND, 8 VIN

## LTC3528-2
designator IC?, comment 1A, 2MHz Synchronous Step-Up DC/DC Converter in 2mm _ 3mm DFN
VALUE2: LTC3528-2; SPICEMODEL: LTC3528-2.sub; SPICEPREFIX: X
footprint DFN8(DDB)
pins: 1 !SHDN, 2 FB, 3 PGOOD, 4 VOUT, 5 SW, 6 PGND, 7 9 SGND, 8 VIN

## LTC3528B
designator IC?, comment LT-Spice library generated with : ltspice.ulp from: D:/Program Files (x86)/LTC/LTspiceIV/lib/sym/PowerProducts/LTC3529*.asy at 07.10.2012 18:15:08
VALUE2: LTC3528B; SPICEMODEL: LTC3528B.sub; SPICEPREFIX: X
footprint DFN8(DDB)
pins: 1 !SHDN, 2 FB, 3 PGOOD, 4 VOUT, 5 SW, 6 PGND, 7 9 SGND, 8 VIN

## LTC3528B-2
designator IC?, comment 1A, 2MHz Synchronous Step-Up DC/DC Converter in 2mm _ 3mm DFN
VALUE2: LTC3528B-2; SPICEMODEL: LTC3528B-2.sub; SPICEPREFIX: X
footprint DFN8(DDB)
pins: 1 !SHDN, 2 FB, 3 PGOOD, 4 VOUT, 5 SW, 6 PGND, 7 9 SGND, 8 VIN

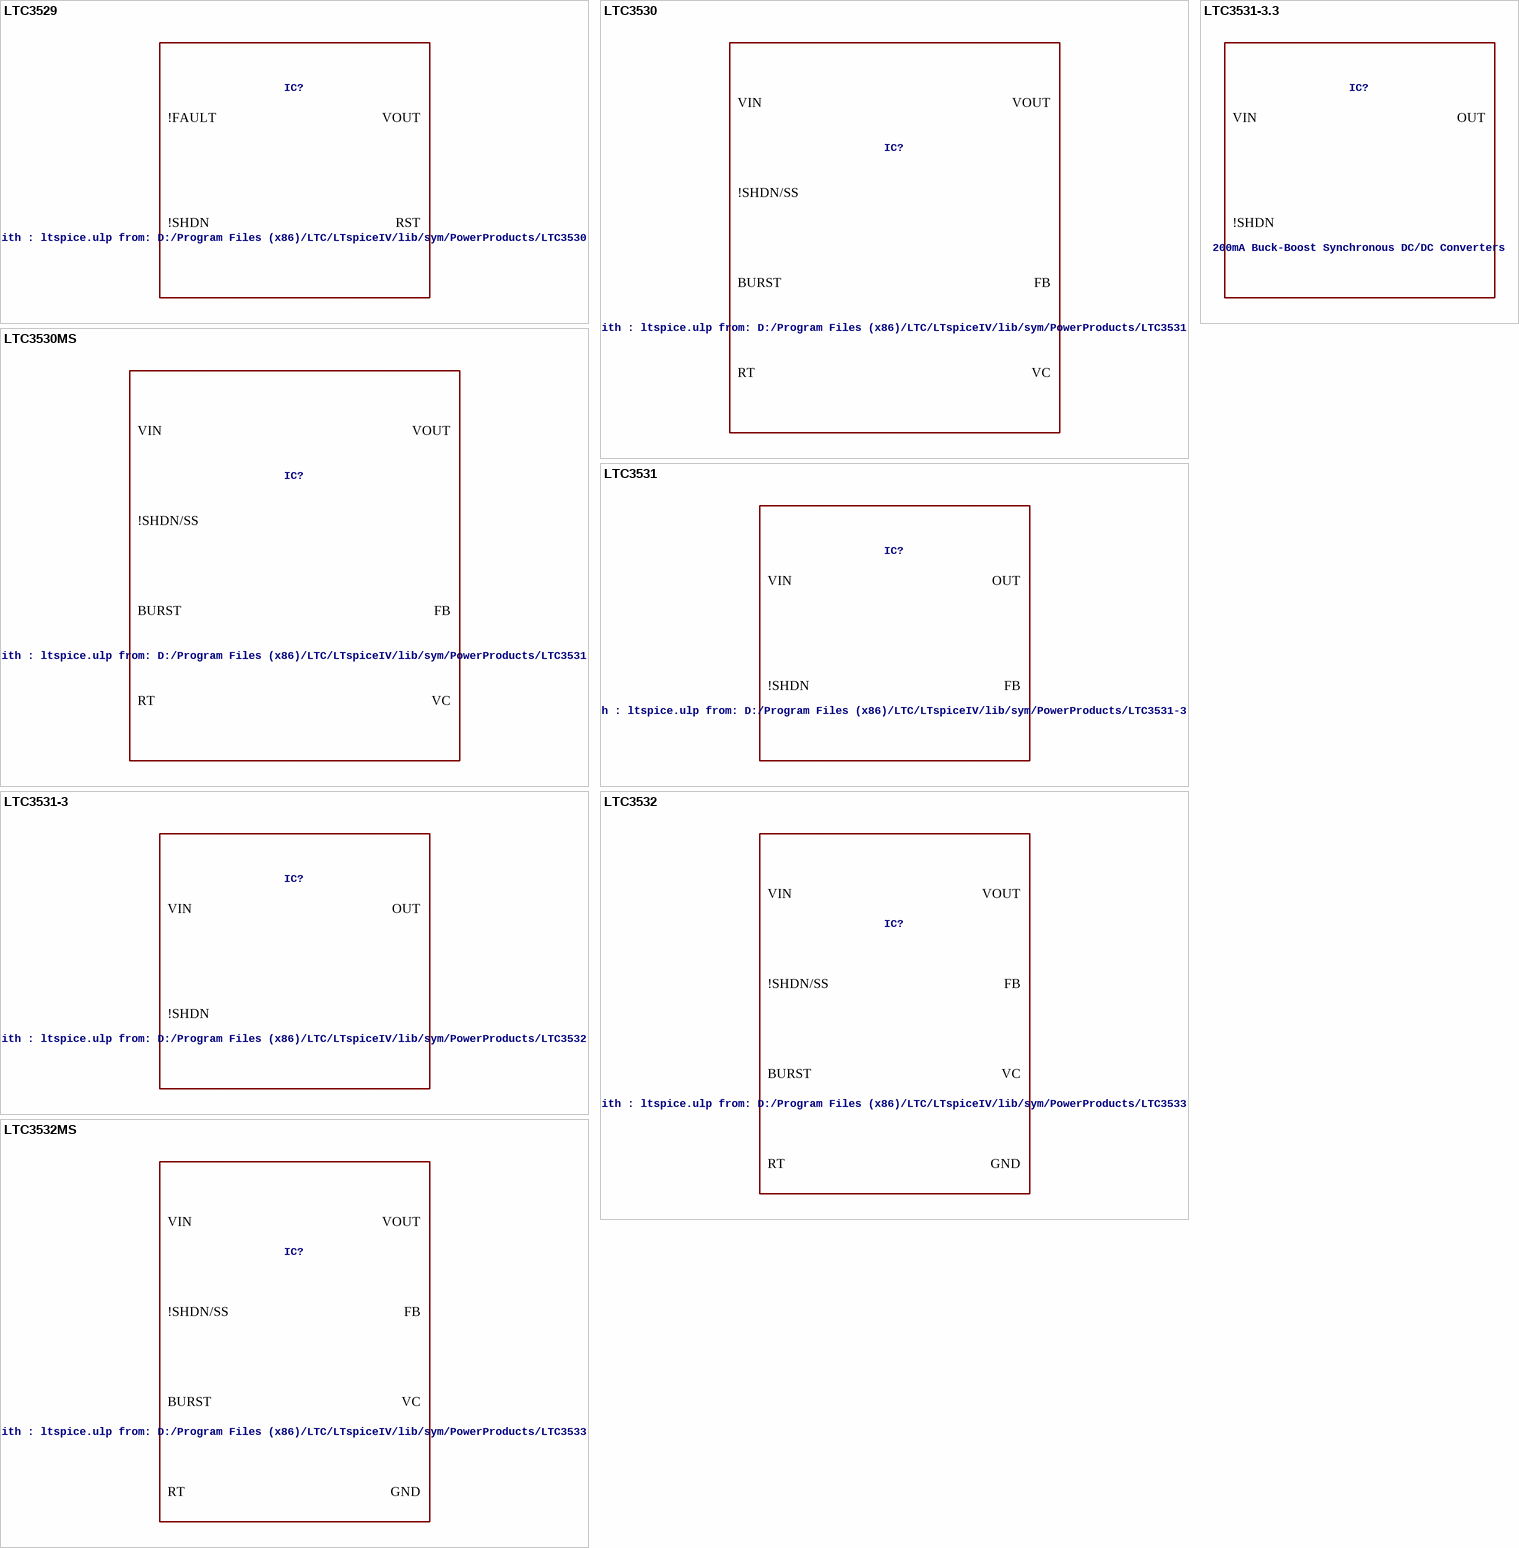
[diagram p49: symbols LTC3529 to LTC3532MS]

## LTC3529
designator IC?, comment LT-Spice library generated with : ltspice.ulp from: D:/Program Files (x86)/LTC/LTspiceIV/lib/sym/PowerProducts/LTC3530*.asy at 07.10.2012 18:15:16
VALUE2: LTC3529; SPICEMODEL: LTC3529.sub; SPICEPREFIX: X
footprint DFN8(DCB)
pins: 1 VOUT, 2 SW, 3 !SHDN, 4 9 PGND, 5 !FAULT, 6 SNSGND, 7 RST, 8 VIN

## LTC3530
designator IC?, comment LT-Spice library generated with : ltspice.ulp from: D:/Program Files (x86)/LTC/LTspiceIV/lib/sym/PowerProducts/LTC3531*.asy at 07.10.2012 18:15:29
VALUE2: LTC3530; SPICEMODEL: LTC3530.sub; SPICEPREFIX: X
footprint DFN10(DD)
pins: 1 RT, 2 BURST, 3 SW1, 4 SW2, 5 11 GND, 6 VOUT, 7 VIN, 8 !SHDN/SS, 9 FB, 10 VC

## LTC3530MS
designator IC?, comment LT-Spice library generated with : ltspice.ulp from: D:/Program Files (x86)/LTC/LTspiceIV/lib/sym/PowerProducts/LTC3531*.asy at 07.10.2012 18:15:29
VALUE2: LTC3530; SPICEMODEL: LTC3530.sub; SPICEPREFIX: X
footprint MSOP10(MS)
pins: 1 RT, 2 BURST, 3 SW1, 4 SW2, 5 GND, 6 VOUT, 7 VIN, 8 !SHDN/SS, 9 FB, 10 VC

## LTC3531
designator IC?, comment LT-Spice library generated with : ltspice.ulp from: D:/Program Files (x86)/LTC/LTspiceIV/lib/sym/PowerProducts/LTC3531-3.3*.asy at 07.10.2012 18:15:39
SPICEMODEL: LTC3531.sub; SPICEPREFIX: X; VALUE2: LTC3531
footprint DFN8(DD)
pins: 1 SW1, 2 VIN, 3 9 GND, 4 !SHDN, 5 FB, 6 OUT, 7 SW2, 8 PGND

## LTC3531-3
designator IC?, comment LT-Spice library generated with : ltspice.ulp from: D:/Program Files (x86)/LTC/LTspiceIV/lib/sym/PowerProducts/LTC3532*.asy at 07.10.2012 18:15:49
VALUE2: LTC3531-X Vout=3; SPICEMODEL: LTC3531-X.sub; SPICEPREFIX: X
footprint DFN8(DD)
pins: 1 SW1, 2 VIN, 3 9 GND, 4 !SHDN, 6 OUT, 7 SW2, 8 PGND

## LTC3531-3.3
designator IC?, comment 200mA Buck-Boost Synchronous DC/DC Converters
VALUE2: LTC3531-X Vout=3.3; SPICEMODEL: LTC3531-X.sub; SPICEPREFIX: X
footprint DFN8(DD)
pins: 1 SW1, 2 VIN, 3 9 GND, 4 !SHDN, 6 OUT, 7 SW2, 8 PGND

## LTC3532
designator IC?, comment LT-Spice library generated with : ltspice.ulp from: D:/Program Files (x86)/LTC/LTspiceIV/lib/sym/PowerProducts/LTC3533*.asy at 07.10.2012 18:15:57
VALUE2: LTC3532; SPICEMODEL: LTC3532.sub; SPICEPREFIX: X
footprint DFN10(DD)
pins: 1 RT, 2 BURST, 3 SW1, 4 SW2, 5 11 GND, 6 VOUT, 7 VIN, 8 !SHDN/SS, 9 FB, 10 VC

## LTC3532MS
designator IC?, comment LT-Spice library generated with : ltspice.ulp from: D:/Program Files (x86)/LTC/LTspiceIV/lib/sym/PowerProducts/LTC3533*.asy at 07.10.2012 18:15:57
VALUE2: LTC3532; SPICEMODEL: LTC3532.sub; SPICEPREFIX: X
footprint MSOP10(MS)
pins: 1 RT, 2 BURST, 3 SW1, 4 SW2, 5 GND, 6 VOUT, 7 VIN, 8 !SHDN/SS, 9 FB, 10 VC

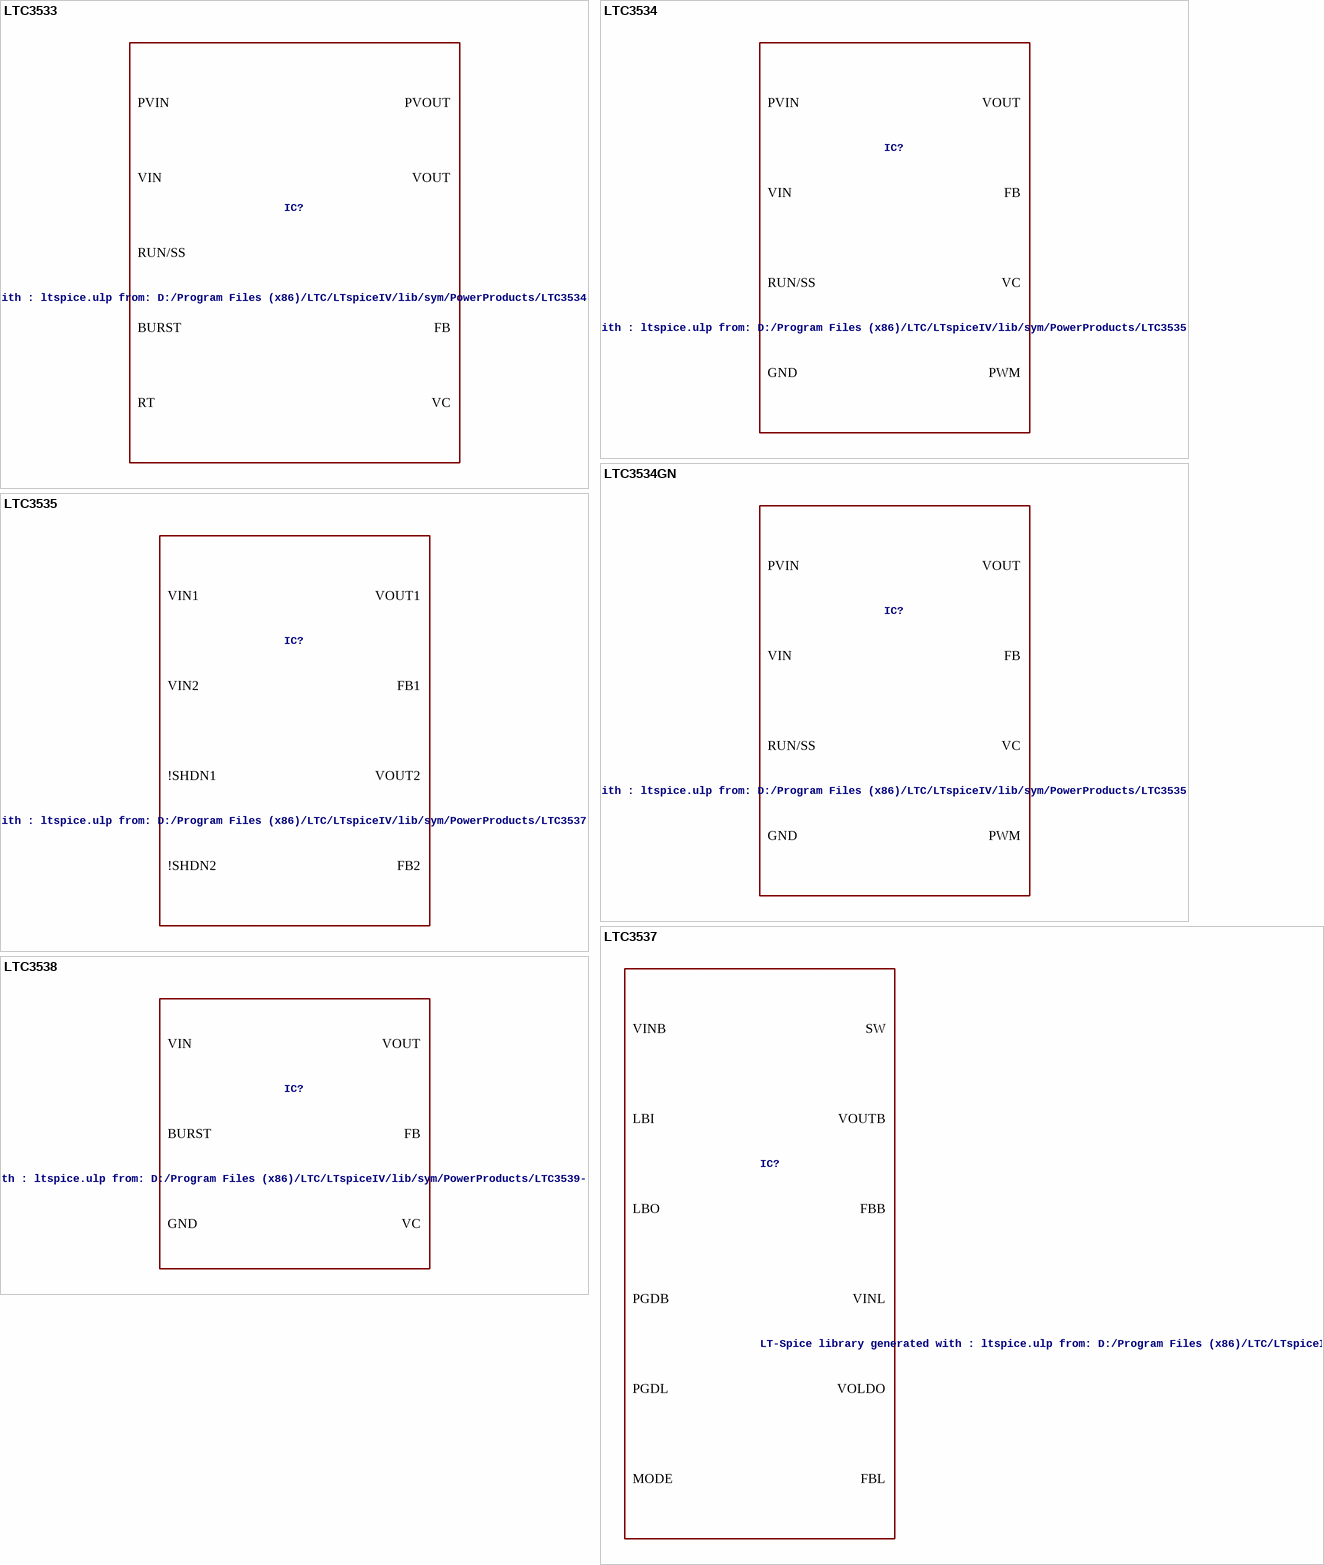
[diagram p50: symbols LTC3533 to LTC3538]

## LTC3533
designator IC?, comment LT-Spice library generated with : ltspice.ulp from: D:/Program Files (x86)/LTC/LTspiceIV/lib/sym/PowerProducts/LTC3534*.asy at 07.10.2012 18:16:04
VALUE2: LTC3533; SPICEMODEL: LTC3533.sub; SPICEPREFIX: X
footprint DFN14(DE)
pins: 1 RT, 2 BURST, 3 15 SGND, 4 SW1, 5 6 PGND, 7 SW2, 8 VOUT, 9 PVOUT, 10 VIN, 11 PVIN, 12 RUN/SS, 13 FB, 14 VC

## LTC3534
designator IC?, comment LT-Spice library generated with : ltspice.ulp from: D:/Program Files (x86)/LTC/LTspiceIV/lib/sym/PowerProducts/LTC3535*.asy at 07.10.2012 18:16:10
VALUE2: LTC3534; SPICEMODEL: LTC3534.sub; SPICEPREFIX: X
footprint DFN16(DHC)
pins: 1 3 8 9 16 17 GND, 2 RUN/SS, 4 PGND1, 5 SW1, 6 SW2, 7 PGND2, 10 PWM, 11 VOUT, 12 PVIN, 13 VIN, 14 VC, 15 FB

## LTC3534GN
designator IC?, comment LT-Spice library generated with : ltspice.ulp from: D:/Program Files (x86)/LTC/LTspiceIV/lib/sym/PowerProducts/LTC3535*.asy at 07.10.2012 18:16:10
VALUE2: LTC3534; SPICEMODEL: LTC3534.sub; SPICEPREFIX: X
footprint SSOP16(GN)
pins: 1 3 8 9 16 GND, 2 RUN/SS, 4 PGND1, 5 SW1, 6 SW2, 7 PGND2, 10 PWM, 11 VOUT, 12 PVIN, 13 VIN, 14 VC, 15 FB

## LTC3535
designator IC?, comment LT-Spice library generated with : ltspice.ulp from: D:/Program Files (x86)/LTC/LTspiceIV/lib/sym/PowerProducts/LTC3537*.asy at 07.10.2012 18:16:16
VALUE2: LTC3535; SPICEMODEL: LTC3535.sub; SPICEPREFIX: X
footprint DFN12(DD)
pins: 1 VOUT1, 2 SW1, 3 13 GND1, 4 VOUT2, 5 SW2, 6 GND2, 7 VIN2, 8 !SHDN2, 9 FB2, 10 VIN1, 11 !SHDN1, 12 FB1

## LTC3537
designator IC?, comment LT-Spice library generated with : ltspice.ulp from: D:/Program Files (x86)/LTC/LTspiceIV/lib/sym/PowerProducts/LTC3538*.asy at 07.10.2012 18:16:23
VALUE2: LTC3537; SPICEMODEL: LTC3537.sub; SPICEPREFIX: X
footprint QFN16(UD)
pins: 1 MODE, 2 LBI, 3 SGND, 4 VINB, 5 PGDB, 6 ENBST, 7 PGDL, 8 ENLDO, 9 FBB, 10 FBL, 11 VOLDO, 12 VINL, 13 VOUTB, 14 SW, 15 17 PGND, 16 LBO

## LTC3538
designator IC?, comment LT-Spice library generated with : ltspice.ulp from: D:/Program Files (x86)/LTC/LTspiceIV/lib/sym/PowerProducts/LTC3539-2*.asy at 07.10.2012 18:16:34
VALUE2: LTC3538; SPICEMODEL: LTC3538.sub; SPICEPREFIX: X
footprint DFN8(DCB)
pins: 1 FB, 2 VC, 3 9 GND, 4 BURST, 5 VOUT, 6 SW2, 7 SW1, 8 VIN

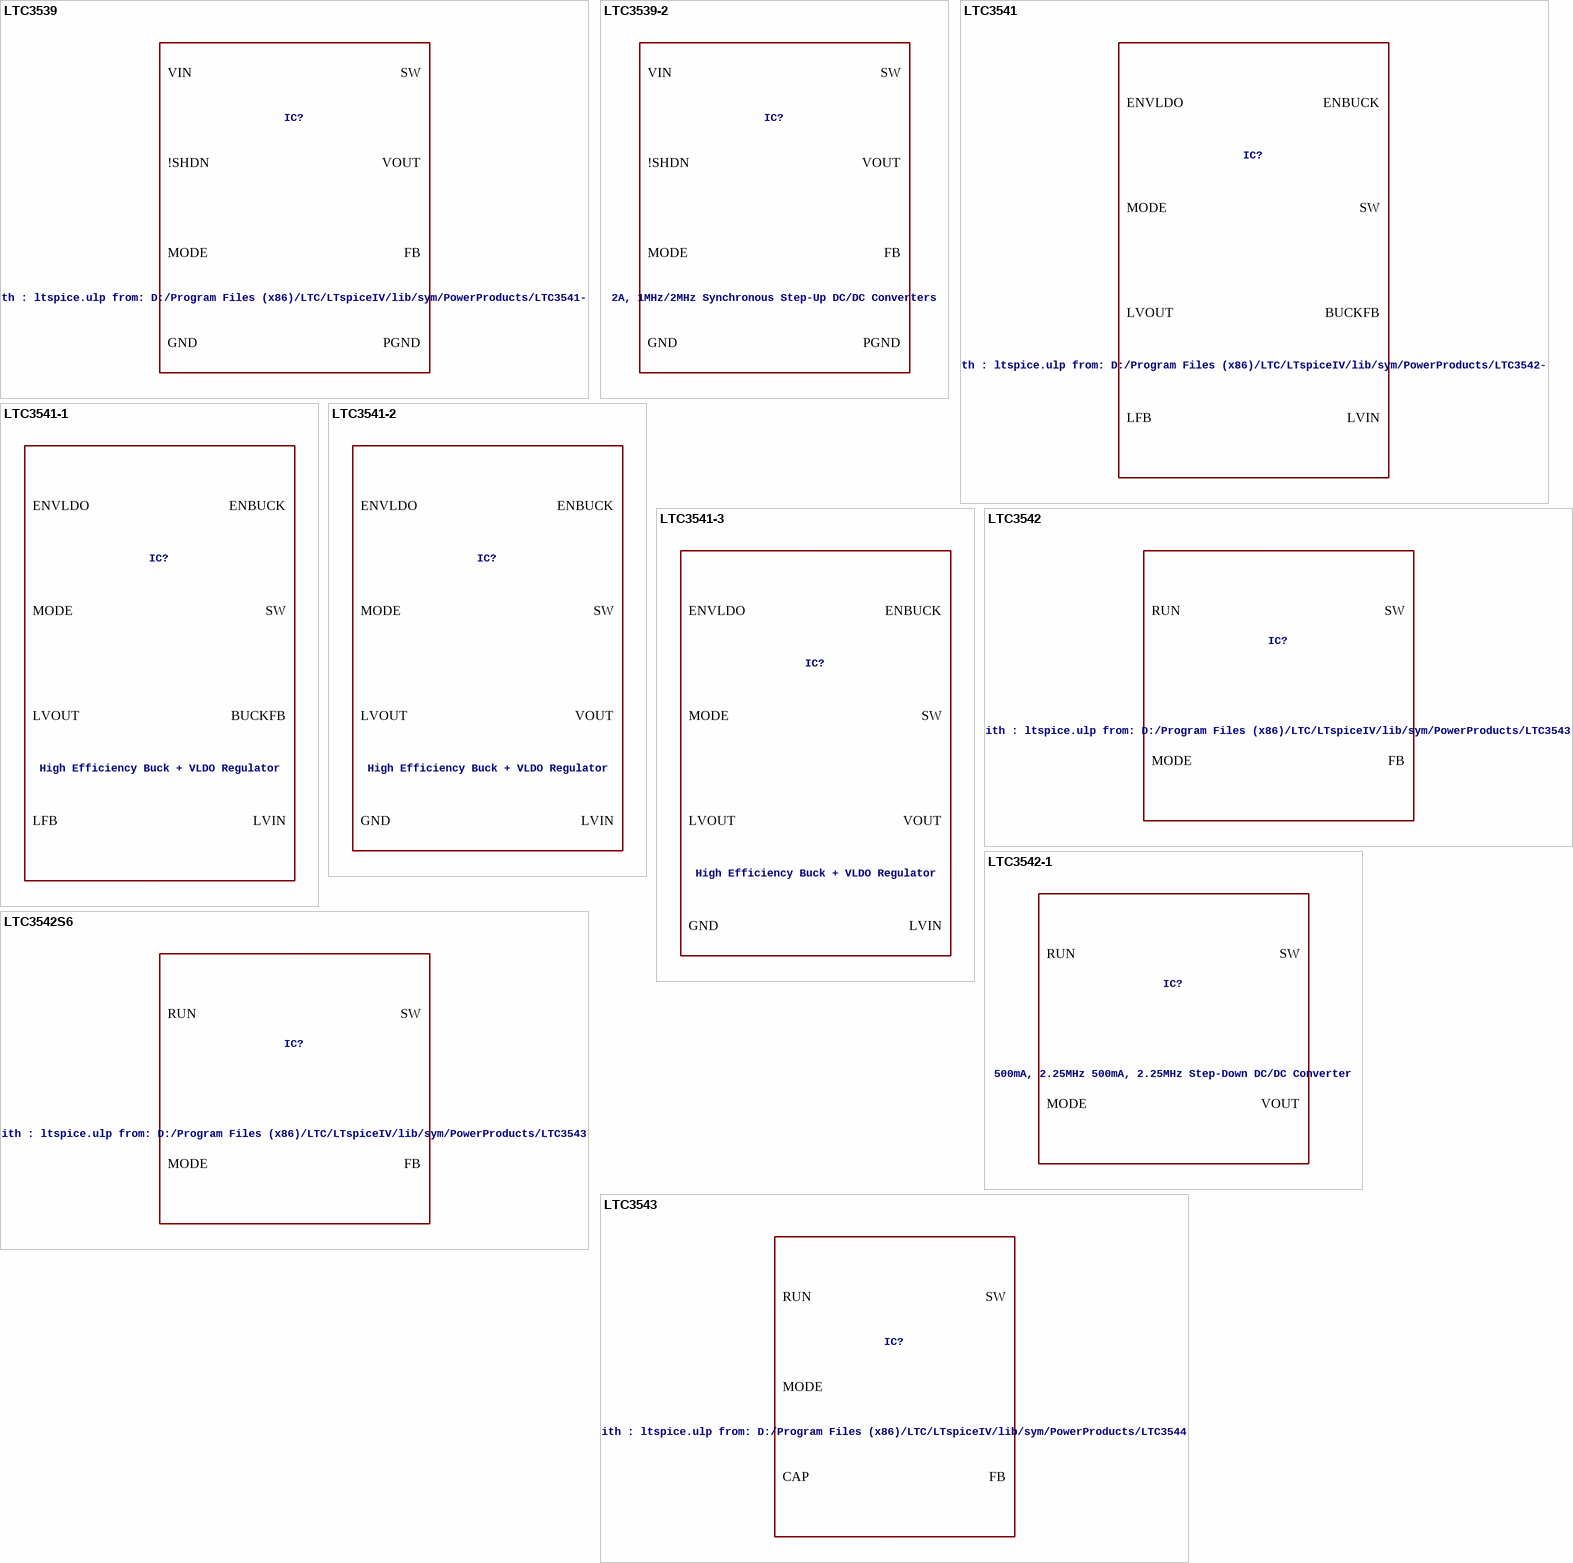
[diagram p51: symbols LTC3539 to LTC3543]

## LTC3539
designator IC?, comment LT-Spice library generated with : ltspice.ulp from: D:/Program Files (x86)/LTC/LTspiceIV/lib/sym/PowerProducts/LTC3541-1*.asy at 07.10.2012 18:16:50
VALUE2: LTC3539; SPICEMODEL: LTC3539.sub; SPICEPREFIX: X
footprint DFN8(DCB)
pins: 1 SW, 2 PGND, 3 9 GND, 4 VIN, 5 !SHDN, 6 FB, 7 MODE, 8 VOUT

## LTC3539-2
designator IC?, comment 2A, 1MHz/2MHz Synchronous Step-Up DC/DC Converters
VALUE2: LTC3539-2; SPICEMODEL: LTC3539-2.sub; SPICEPREFIX: X
footprint DFN8(DCB)
pins: 1 SW, 2 PGND, 3 9 GND, 4 VIN, 5 !SHDN, 6 FB, 7 MODE, 8 VOUT

## LTC3541
designator IC?, comment LT-Spice library generated with : ltspice.ulp from: D:/Program Files (x86)/LTC/LTspiceIV/lib/sym/PowerProducts/LTC3542-1*.asy at 07.10.2012 18:17:04
VALUE2: LTC3541; SPICEMODEL: LTC3541.sub; SPICEPREFIX: X
footprint DFN10(DD)
pins: 1 VIN, 2 ENBUCK, 3 BUCKFB, 4 LFB, 5 LVOUT, 6 LVIN, 7 11 GND, 8 MODE, 9 ENVLDO, 10 SW

## LTC3541-1
designator IC?, comment High Efficiency Buck + VLDO Regulator
VALUE2: LTC3541-1; SPICEMODEL: LTC3541-1.sub; SPICEPREFIX: X
footprint DFN10(DD)
pins: 1 VIN, 2 ENBUCK, 3 BUCKFB, 4 LFB, 5 LVOUT, 6 LVIN, 7 11 GND, 8 MODE, 9 ENVLDO, 10 SW

## LTC3541-2
designator IC?, comment High Efficiency Buck + VLDO Regulator
VALUE2: LTC3541-2; SPICEMODEL: LTC3541-2.sub; SPICEPREFIX: X
footprint DFN10(DD)
pins: 1 VIN, 2 ENBUCK, 3 VOUT, 5 LVOUT, 6 LVIN, 7 11 GND, 8 MODE, 9 ENVLDO, 10 SW

## LTC3541-3
designator IC?, comment High Efficiency Buck + VLDO Regulator
VALUE2: LTC3541-3; SPICEMODEL: LTC3541-3.sub; SPICEPREFIX: X
footprint DFN10(DD)
pins: 1 VIN, 2 ENBUCK, 3 VOUT, 5 LVOUT, 6 LVIN, 7 11 GND, 8 MODE, 9 ENVLDO, 10 SW

## LTC3542
designator IC?, comment LT-Spice library generated with : ltspice.ulp from: D:/Program Files (x86)/LTC/LTspiceIV/lib/sym/PowerProducts/LTC3543*.asy at 07.10.2012 18:17:14
VALUE2: LTC3542; SPICEMODEL: LTC3542.sub; SPICEPREFIX: X
footprint DFN6(DC)
pins: 1 FB, 2 VIN, 3 7 GND, 4 SW, 5 MODE, 6 RUN

## LTC3542-1
designator IC?, comment 500mA, 2.25MHz 500mA, 2.25MHz Step-Down DC/DC Converter
VALUE2: LTC3542-1; SPICEMODEL: LTC3542-1.sub; SPICEPREFIX: X
footprint DFN6(DC)
pins: 1 VOUT, 2 VIN, 3 7 GND, 4 SW, 5 MODE, 6 RUN

## LTC3542S6
designator IC?, comment LT-Spice library generated with : ltspice.ulp from: D:/Program Files (x86)/LTC/LTspiceIV/lib/sym/PowerProducts/LTC3543*.asy at 07.10.2012 18:17:14
VALUE2: LTC3542; SPICEMODEL: LTC3542.sub; SPICEPREFIX: X
footprint SOT6(S6)
pins: 1 VIN, 2 GND, 3 FB, 4 RUN, 5 MODE, 6 SW

## LTC3543
designator IC?, comment LT-Spice library generated with : ltspice.ulp from: D:/Program Files (x86)/LTC/LTspiceIV/lib/sym/PowerProducts/LTC3544*.asy at 07.10.2012 18:17:22
VALUE2: LTC3543; SPICEMODEL: LTC3543.sub; SPICEPREFIX: X
footprint DFN6(DCB)
pins: 1 SW, 2 CAP, 3 MODE, 4 FB, 5 RUN, 6 VIN, 7 GND

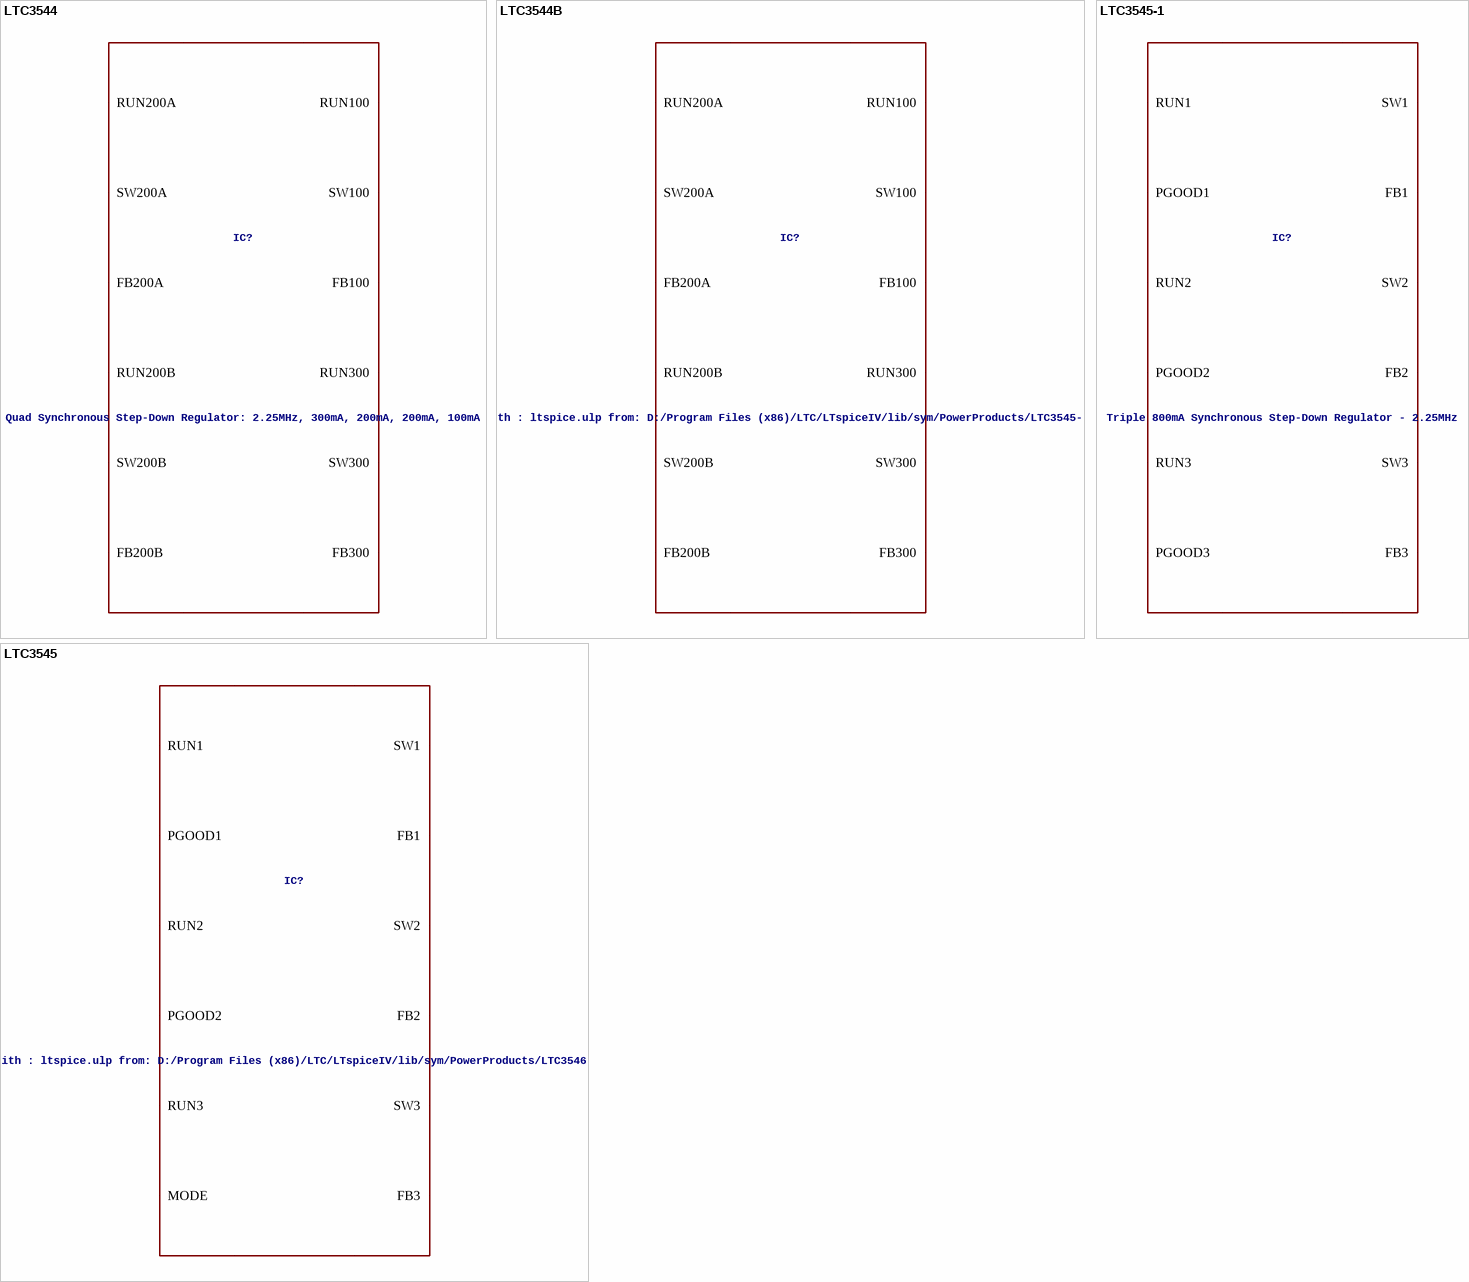
[diagram p52: symbols LTC3544 to LTC3545-1]

## LTC3544
designator IC?, comment Quad Synchronous Step-Down Regulator: 2.25MHz, 300mA, 200mA, 200mA, 100mA
VALUE2: LTC3544; SPICEMODEL: LTC3544.sub; SPICEPREFIX: X
footprint QFN16(UD)
pins: 1 FB200B, 2 FB200A, 3 RUN200A, 4 SW200B, 5 SW200A, 6 PGND, 7 PVIN, 8 SW300, 9 RUN300, 10 FB300, 11 FB100, 12 RUN100, 13 SW100, 14 17 GNDA, 15 VCC, 16 RUN200B

## LTC3544B
designator IC?, comment LT-Spice library generated with : ltspice.ulp from: D:/Program Files (x86)/LTC/LTspiceIV/lib/sym/PowerProducts/LTC3545-1*.asy at 07.10.2012 18:17:32
VALUE2: LTC3544B; SPICEMODEL: LTC3544B.sub; SPICEPREFIX: X
footprint QFN16(UD)
pins: 1 FB200B, 2 FB200A, 3 RUN200A, 4 SW200B, 5 SW200A, 6 PGND, 7 PVIN, 8 SW300, 9 RUN300, 10 FB300, 11 FB100, 12 RUN100, 13 SW100, 14 17 GNDA, 15 VCC, 16 RUN200B

## LTC3545
designator IC?, comment LT-Spice library generated with : ltspice.ulp from: D:/Program Files (x86)/LTC/LTspiceIV/lib/sym/PowerProducts/LTC3546*.asy at 07.10.2012 18:17:39
VALUE2: LTC3545; SPICEMODEL: LTC3545.sub; SPICEPREFIX: X
footprint QFN16(UD)
pins: 1 SW1, 2 PGOOD1, 3 RUN2, 4 PGOOD2, 5 SW2, 6 PGND, 7 PVIN, 8 SW3, 9 MODE, 10 RUN3, 11 FB3, 12 FB2, 13 FB1, 14 RUN1, 15 VIN, 16 17 GNDA

## LTC3545-1
designator IC?, comment Triple 800mA Synchronous Step-Down Regulator - 2.25MHz
VALUE2: LTC3545-1; SPICEMODEL: LTC3545-1.sub; SPICEPREFIX: X
footprint QFN16(UD)
pins: 1 SW1, 2 PGOOD1, 3 RUN2, 4 PGOOD2, 5 SW2, 6 PGND, 7 PVIN, 8 SW3, 9 PGOOD3, 10 RUN3, 11 FB3, 12 FB2, 13 FB1, 14 RUN1, 15 VIN, 16 17 GNDA

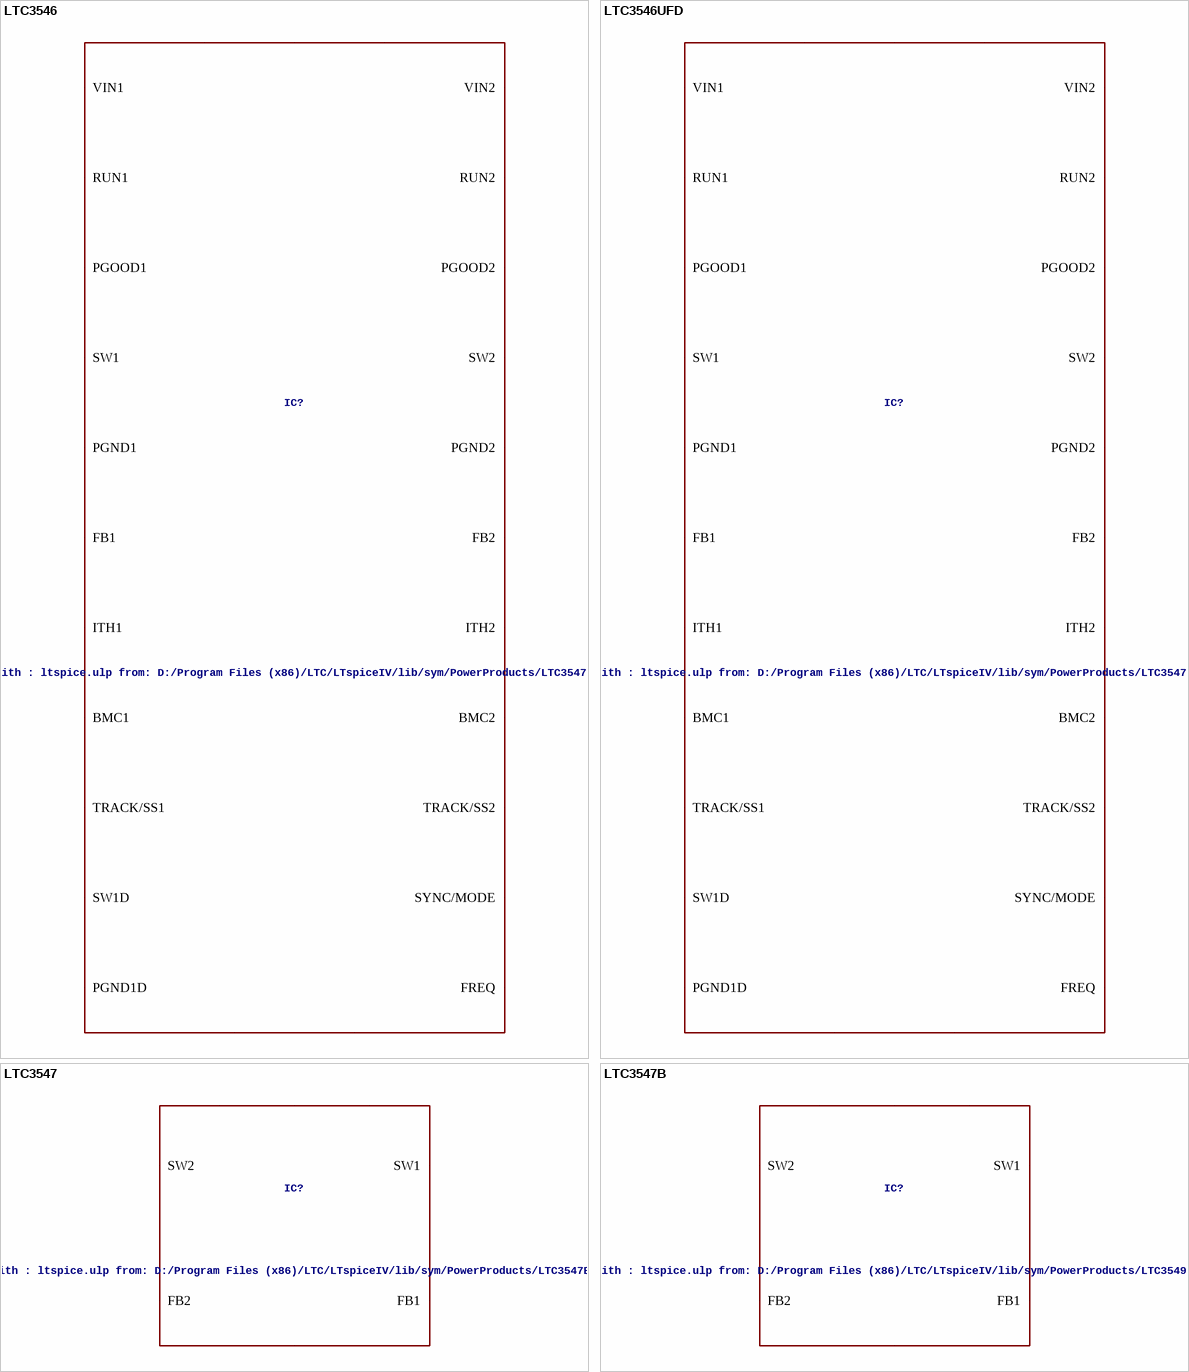
[diagram p53: symbols LTC3546 to LTC3547B]

## LTC3546
designator IC?, comment LT-Spice library generated with : ltspice.ulp from: D:/Program Files (x86)/LTC/LTspiceIV/lib/sym/PowerProducts/LTC3547*.asy at 07.10.2012 18:17:48
VALUE2: LTC3546; SPICEMODEL: LTC3546.sub; SPICEPREFIX: X
footprint TSSOP28EB(FE)
pins: 1 VCCA, 2 SYNC/MODE, 3 PGOOD2, 4 BMC2, 5 TRACK/SS2, 6 FB2, 7 ITH2, 8 VCCD, 9 RUN2, 10 VIN2, 11 VIN1, 12 VIN1D, 13 14 SW2, 15 SW1D, 16 SW1, 17 PGND1D, 18 PGND1, 19 29 PGND2, 20 RUN1, 21 PHASE, 22 ITH1, 23 FB1, 24 TRACK/SS1, 25 BMC1, 26 PGOOD1, 27 FREQ, 28 GNDA

## LTC3546UFD
designator IC?, comment LT-Spice library generated with : ltspice.ulp from: D:/Program Files (x86)/LTC/LTspiceIV/lib/sym/PowerProducts/LTC3547*.asy at 07.10.2012 18:17:48
VALUE2: LTC3546; SPICEMODEL: LTC3546.sub; SPICEPREFIX: X
footprint QFN28(UFD)
pins: 1 BMC2, 2 TRACK/SS2, 3 FB2, 4 ITH2, 5 VCCD, 6 RUN2, 7 VIN2, 8 VIN1, 9 VIN1D, 10 11 SW2, 12 SW1D, 13 SW1, 14 PGND1D, 15 PGND1, 16 29 PGND2, 17 RUN1, 18 PHASE, 19 ITH1, 20 FB1, 21 TRACK/SS1, 22 BMC1, 23 PGOOD1, 24 FREQ, 25 GNDA, 26 VCCA, 27 SYNC/MODE, 28 PGOOD2

## LTC3547
designator IC?, comment LT-Spice library generated with : ltspice.ulp from: D:/Program Files (x86)/LTC/LTspiceIV/lib/sym/PowerProducts/LTC3547B*.asy at 07.10.2012 18:17:57
SPICEMODEL: LTC3547.sub; SPICEPREFIX: X; VALUE2: LTC3547
footprint DFN8(DDB)
pins: 1 FB1, 2 RUN1, 3 VIN, 4 SW1, 5 9 GND, 6 SW2, 7 RUN2, 8 FB2

## LTC3547B
designator IC?, comment LT-Spice library generated with : ltspice.ulp from: D:/Program Files (x86)/LTC/LTspiceIV/lib/sym/PowerProducts/LTC3549*.asy at 07.10.2012 18:18:08
VALUE2: LTC3547B; SPICEMODEL: LTC3547B.sub; SPICEPREFIX: X
footprint DFN8(DDB)
pins: 1 FB1, 2 RUN1, 3 VIN, 4 SW1, 5 9 GND, 6 SW2, 7 RUN2, 8 FB2

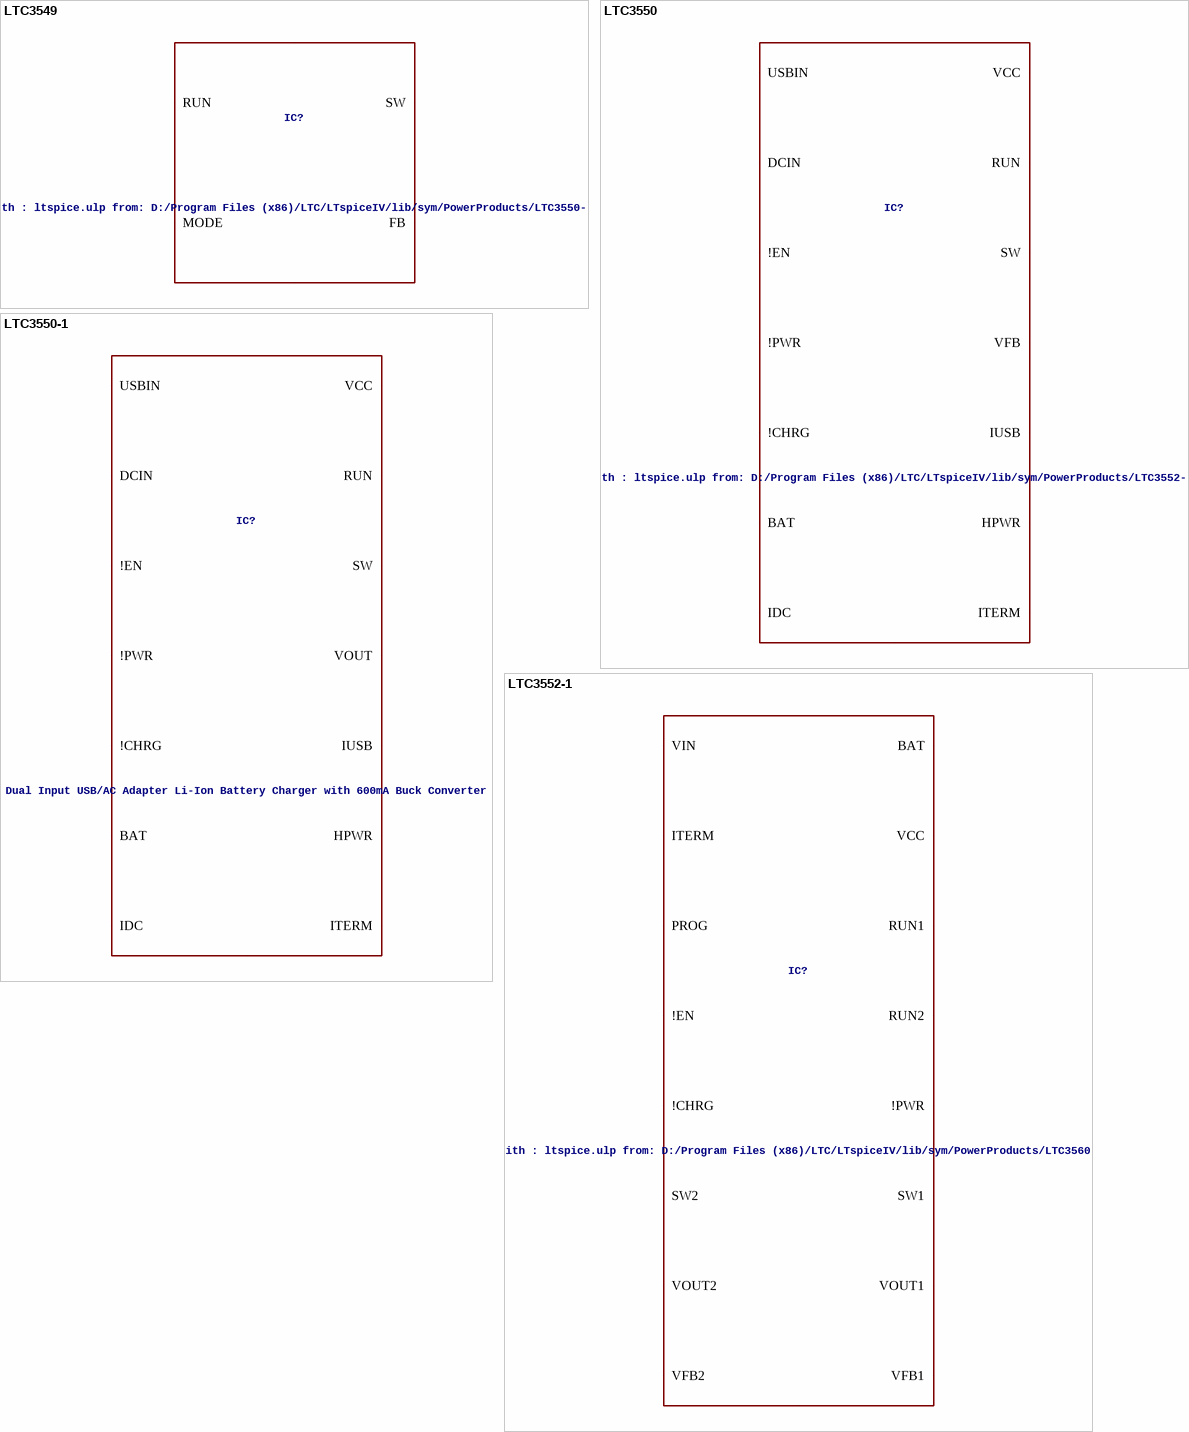
[diagram p54: symbols LTC3549 to LTC3552-1]

## LTC3549
designator IC?, comment LT-Spice library generated with : ltspice.ulp from: D:/Program Files (x86)/LTC/LTspiceIV/lib/sym/PowerProducts/LTC3550-1*.asy at 07.10.2012 18:18:26
VALUE2: LTC3549; SPICEMODEL: LTC3549.sub; SPICEPREFIX: X
footprint DFN6(DCB)
pins: 1 VIN, 2 7 GND, 3 SW, 4 MODE, 5 RUN, 6 FB

## LTC3550
designator IC?, comment LT-Spice library generated with : ltspice.ulp from: D:/Program Files (x86)/LTC/LTspiceIV/lib/sym/PowerProducts/LTC3552-1*.asy at 07.10.2012 18:18:53
VALUE2: LTC3550; SPICEMODEL: LTC3550.sub; SPICEPREFIX: X
footprint DFN16(DHC)
pins: 1 USBIN, 2 IUSB, 3 ITERM, 4 !PWR, 5 !CHRG, 6 VFB, 7 VCC, 8 9 17 GND, 10 SW, 11 RUN, 12 !EN, 13 HPWR, 14 IDC, 15 BAT, 16 DCIN

## LTC3550-1
designator IC?, comment Dual Input USB/AC Adapter Li-Ion Battery Charger with 600mA Buck Converter
VALUE2: LTC3550-1; SPICEMODEL: LTC3550-1.sub; SPICEPREFIX: X
footprint DFN16(DHC)
pins: 1 USBIN, 2 IUSB, 3 ITERM, 4 !PWR, 5 !CHRG, 6 VOUT, 7 VCC, 8 9 17 GND, 10 SW, 11 RUN, 12 !EN, 13 HPWR, 14 IDC, 15 BAT, 16 DCIN

## LTC3552-1
designator IC?, comment LT-Spice library generated with : ltspice.ulp from: D:/Program Files (x86)/LTC/LTspiceIV/lib/sym/PowerProducts/LTC3560*.asy at 07.10.2012 18:19:06
VALUE2: LTC3552-1; SPICEMODEL: LTC3552-1.sub; SPICEPREFIX: X
footprint DFN16(DHC)
pins: 1 ITERM, 2 BAT, 3 !CHRG, 4 RUN2, 5 SW2, 6 RUN1, 7 VOUT2, 8 VFB2, 9 VFB1, 10 VOUT1, 11 VCC, 12 SW1, 13 PROG, 14 VIN, 15 !PWR, 16 !EN, 17 GND

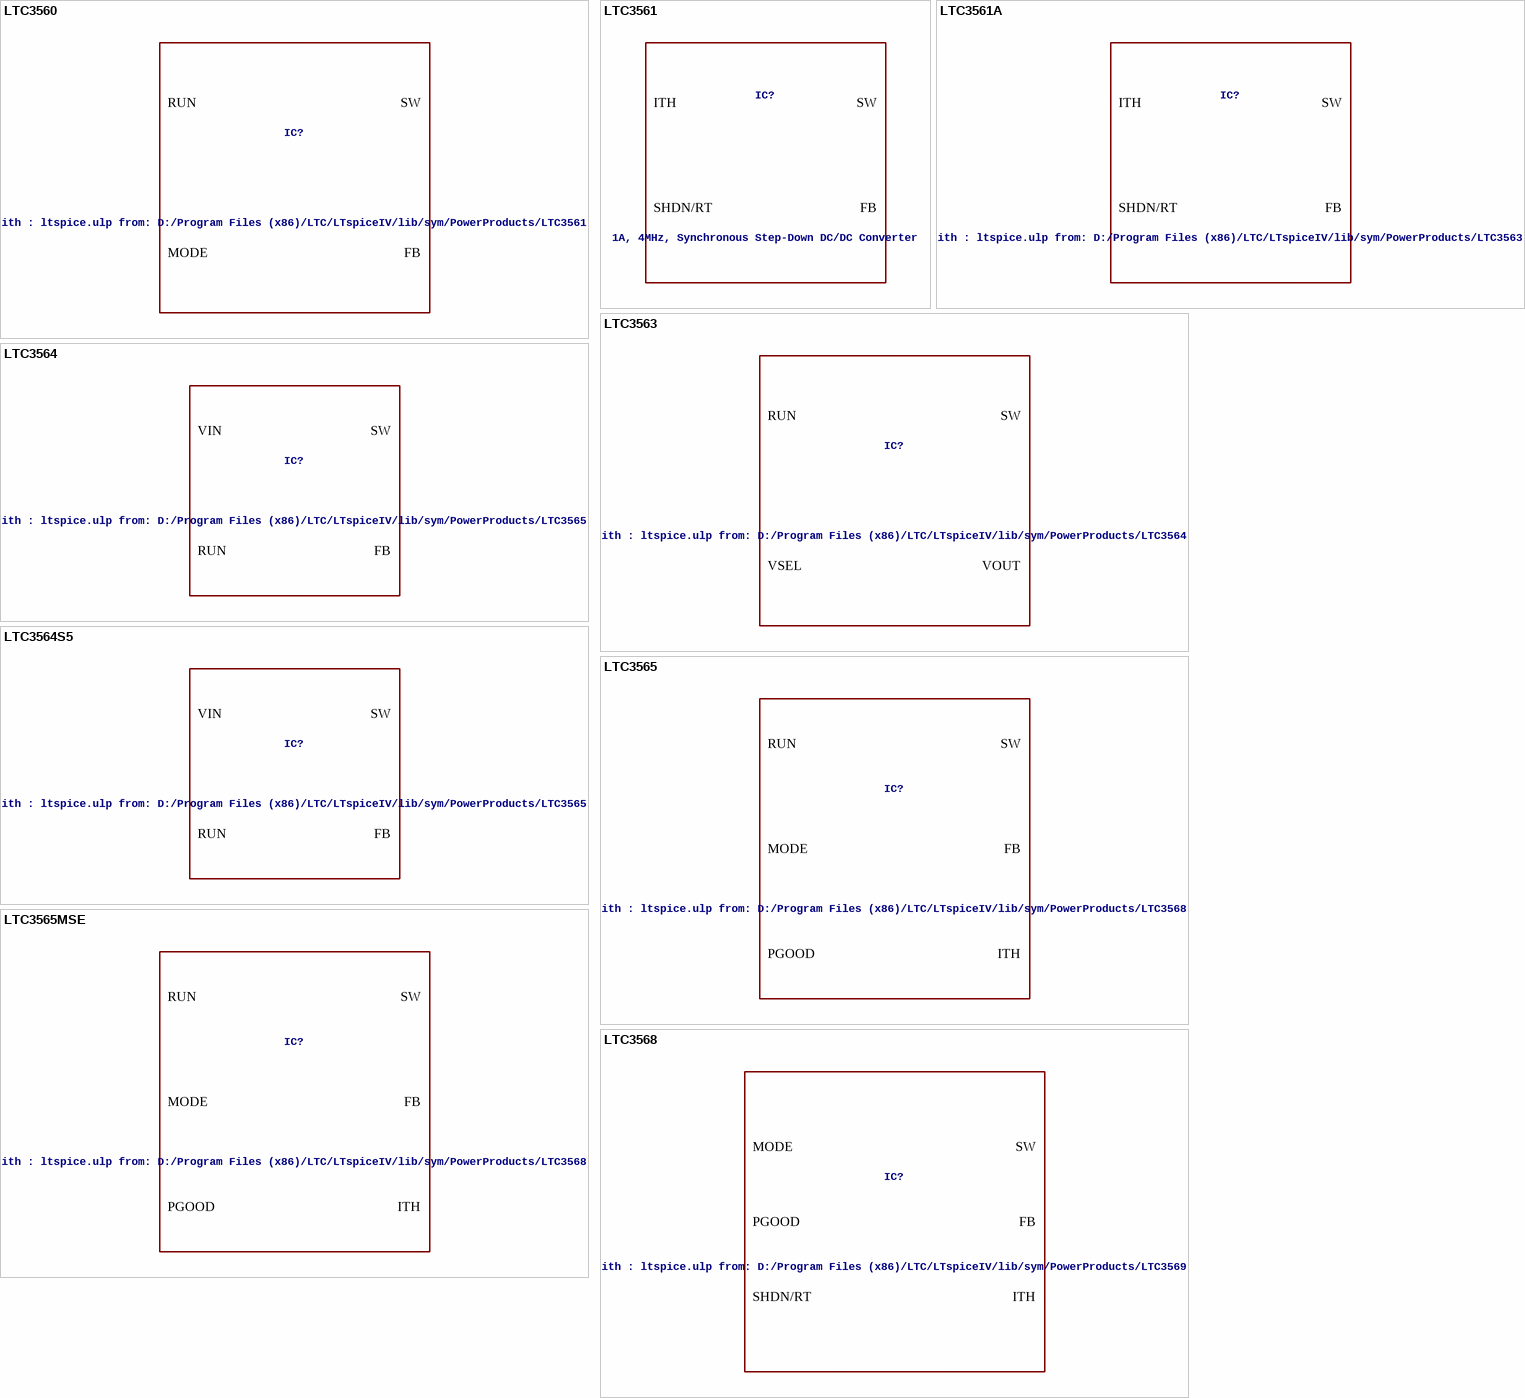
[diagram p55: symbols LTC3560 to LTC3568]

## LTC3560
designator IC?, comment LT-Spice library generated with : ltspice.ulp from: D:/Program Files (x86)/LTC/LTspiceIV/lib/sym/PowerProducts/LTC3561*.asy at 07.10.2012 18:19:20
VALUE2: LTC3560; SPICEMODEL: LTC3560.sub; SPICEPREFIX: X
footprint SOT6(S6)
pins: 1 RUN, 2 GND, 3 SW, 4 VIN, 5 FB, 6 MODE

## LTC3561
designator IC?, comment 1A, 4MHz, Synchronous Step-Down DC/DC Converter
VALUE2: LTC3561; SPICEMODEL: LTC3561.sub; SPICEPREFIX: X
footprint DFN8(DD)
pins: 1 SHDN/RT, 2 9 SGND, 3 SW, 4 PGND, 5 PVIN, 6 SVIN, 7 FB, 8 ITH

## LTC3561A
designator IC?, comment LT-Spice library generated with : ltspice.ulp from: D:/Program Files (x86)/LTC/LTspiceIV/lib/sym/PowerProducts/LTC3563*.asy at 07.10.2012 18:19:39
VALUE2: LTC3561A; SPICEMODEL: LTC3561A.sub; SPICEPREFIX: X
footprint DFN8(DD)
pins: 1 SHDN/RT, 2 9 SGND, 3 SW, 4 PGND, 5 PVIN, 6 SVIN, 7 FB, 8 ITH

## LTC3563
designator IC?, comment LT-Spice library generated with : ltspice.ulp from: D:/Program Files (x86)/LTC/LTspiceIV/lib/sym/PowerProducts/LTC3564*.asy at 07.10.2012 18:19:45
VALUE2: LTC3563; SPICEMODEL: LTC3563.sub; SPICEPREFIX: X
footprint DFN6(DC)
pins: 1 VOUT, 2 VIN, 3 7 GND, 4 SW, 5 VSEL, 6 RUN

## LTC3564
designator IC?, comment LT-Spice library generated with : ltspice.ulp from: D:/Program Files (x86)/LTC/LTspiceIV/lib/sym/PowerProducts/LTC3565*.asy at 07.10.2012 18:19:52
VALUE2: LTC3564; SPICEMODEL: LTC3564.sub; SPICEPREFIX: X
footprint DFN6(DCB)
pins: 1 SW, 2 5 7 GND, 3 VIN, 4 FB, 6 RUN

## LTC3564S5
designator IC?, comment LT-Spice library generated with : ltspice.ulp from: D:/Program Files (x86)/LTC/LTspiceIV/lib/sym/PowerProducts/LTC3565*.asy at 07.10.2012 18:19:52
VALUE2: LTC3564; SPICEMODEL: LTC3564.sub; SPICEPREFIX: X
footprint SOT5(S5)
pins: 1 FB, 2 GND, 3 VIN, 4 SW, 5 RUN

## LTC3565
designator IC?, comment LT-Spice library generated with : ltspice.ulp from: D:/Program Files (x86)/LTC/LTspiceIV/lib/sym/PowerProducts/LTC3568*.asy at 07.10.2012 18:20:01
VALUE2: LTC3565; SPICEMODEL: LTC3565.sub; SPICEPREFIX: X
footprint DFN10(DD)
pins: 1 RT, 2 RUN, 3 MODE, 4 SW, 5 11 GND, 6 PVIN, 7 SVIN, 8 PGOOD, 9 FB, 10 ITH

## LTC3565MSE
designator IC?, comment LT-Spice library generated with : ltspice.ulp from: D:/Program Files (x86)/LTC/LTspiceIV/lib/sym/PowerProducts/LTC3568*.asy at 07.10.2012 18:20:01
VALUE2: LTC3565; SPICEMODEL: LTC3565.sub; SPICEPREFIX: X
footprint MSOP10(MSE)
pins: 1 RT, 2 RUN, 3 MODE, 4 SW, 5 11 GND, 6 PVIN, 7 SVIN, 8 PGOOD, 9 FB, 10 ITH

## LTC3568
designator IC?, comment LT-Spice library generated with : ltspice.ulp from: D:/Program Files (x86)/LTC/LTspiceIV/lib/sym/PowerProducts/LTC3569*.asy at 07.10.2012 18:20:10
VALUE2: LTC3568; SPICEMODEL: LTC3568.sub; SPICEPREFIX: X
footprint DFN10(DD)
pins: 1 SHDN/RT, 2 MODE, 3 11 SGND, 4 SW, 5 PGND, 6 PVIN, 7 SVIN, 8 PGOOD, 9 FB, 10 ITH

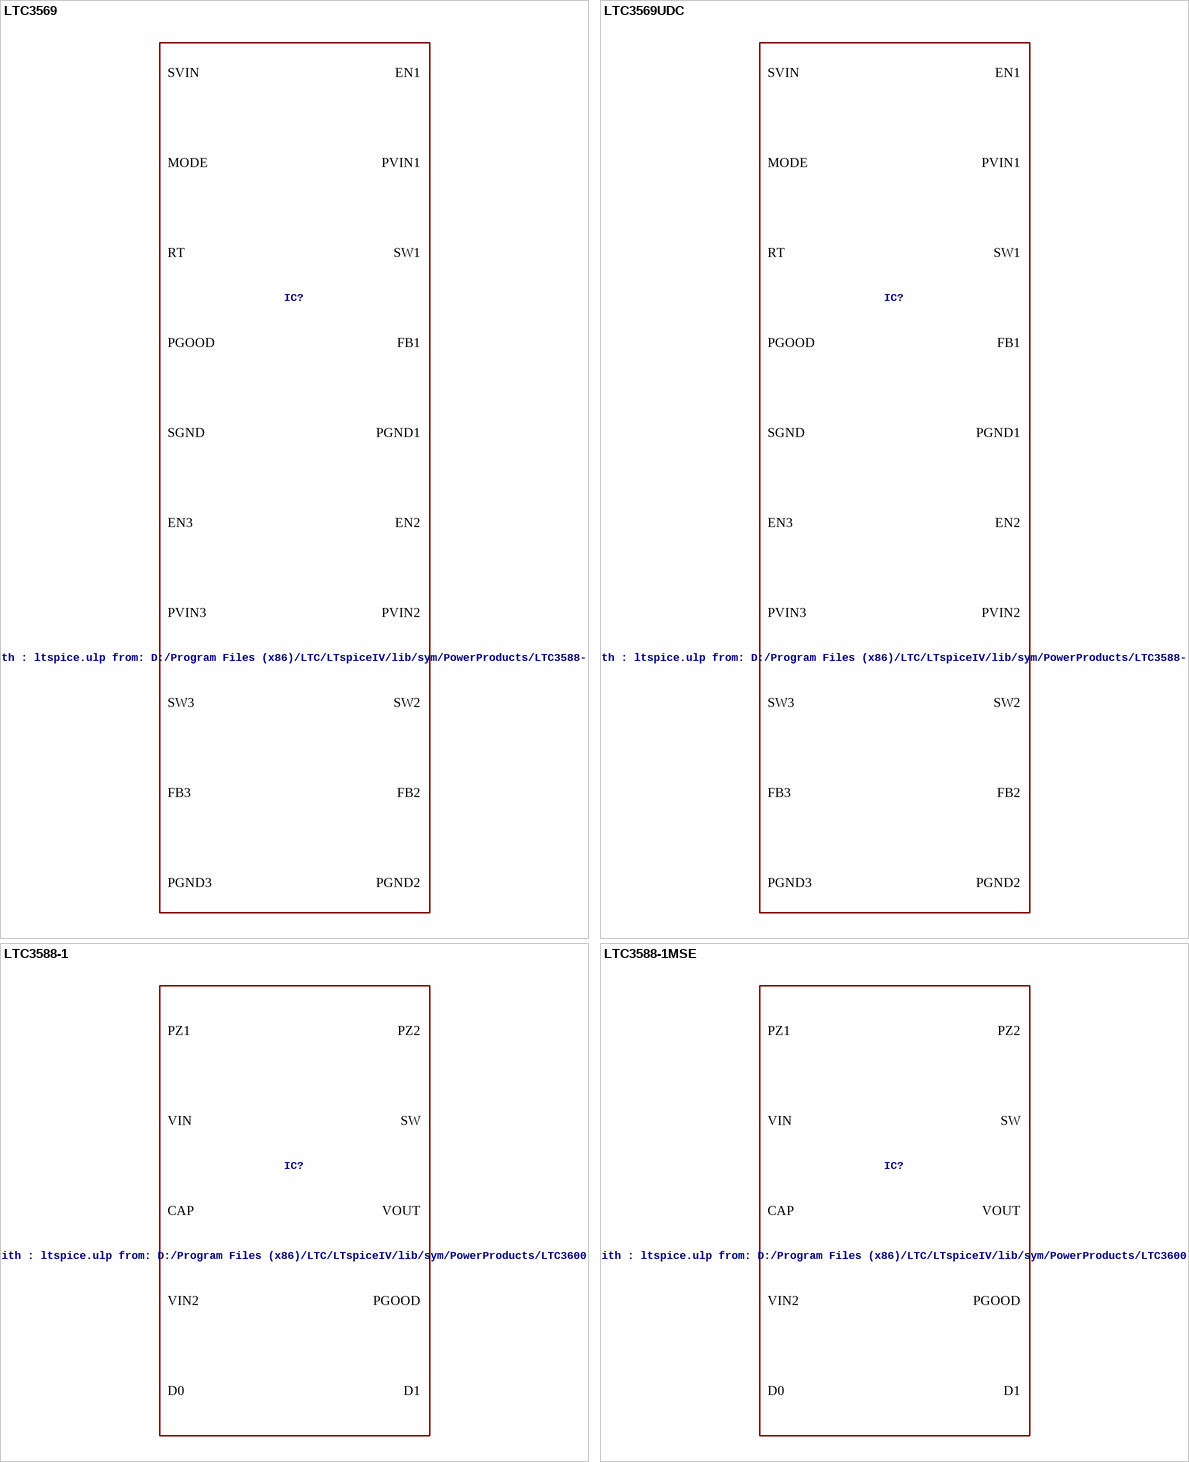
[diagram p56: symbols LTC3569 to LTC3588-1MSE]

## LTC3569
designator IC?, comment LT-Spice library generated with : ltspice.ulp from: D:/Program Files (x86)/LTC/LTspiceIV/lib/sym/PowerProducts/LTC3588-1*.asy at 07.10.2012 18:20:25
VALUE2: LTC3569; SPICEMODEL: LTC3569.sub; SPICEPREFIX: X
footprint QFN20(UD)
pins: 1 SW2, 2 PVIN2, 3 PGOOD, 4 MODE, 5 RT, 6 FB2, 7 FB1, 8 FB3, 9 SVIN, 10 21 SGND, 11 EN3, 12 EN2, 13 EN1, 14 PGND3, 15 SW3, 16 PVIN3, 17 PVIN1, 18 SW1, 19 PGND1, 20 PGND2

## LTC3569UDC
designator IC?, comment LT-Spice library generated with : ltspice.ulp from: D:/Program Files (x86)/LTC/LTspiceIV/lib/sym/PowerProducts/LTC3588-1*.asy at 07.10.2012 18:20:25
VALUE2: LTC3569; SPICEMODEL: LTC3569.sub; SPICEPREFIX: X
footprint QFN20(UDC)
pins: 1 PGND2, 2 SW2, 3 PVIN2, 4 PGOOD, 5 MODE, 6 RT, 7 FB2, 8 FB1, 9 FB3, 10 SVIN, 11 21 SGND, 12 EN3, 13 EN2, 14 EN1, 15 PGND3, 16 SW3, 17 PVIN3, 18 PVIN1, 19 SW1, 20 PGND1

## LTC3588-1
designator IC?, comment LT-Spice library generated with : ltspice.ulp from: D:/Program Files (x86)/LTC/LTspiceIV/lib/sym/PowerProducts/LTC3600*.asy at 07.10.2012 18:20:48
VALUE2: LTC3588-1; SPICEMODEL: LTC3588-1.sub; SPICEPREFIX: X
footprint DFN10(DD)
pins: 1 PZ1, 2 PZ2, 3 CAP, 4 VIN, 5 SW, 6 VOUT, 7 VIN2, 8 D1, 9 D0, 10 PGOOD, 11 GND

## LTC3588-1MSE
designator IC?, comment LT-Spice library generated with : ltspice.ulp from: D:/Program Files (x86)/LTC/LTspiceIV/lib/sym/PowerProducts/LTC3600*.asy at 07.10.2012 18:20:48
VALUE2: LTC3588-1; SPICEMODEL: LTC3588-1.sub; SPICEPREFIX: X
footprint MSOP10(MSE)
pins: 1 PZ1, 2 PZ2, 3 CAP, 4 VIN, 5 SW, 6 VOUT, 7 VIN2, 8 D1, 9 D0, 10 PGOOD, 11 GND

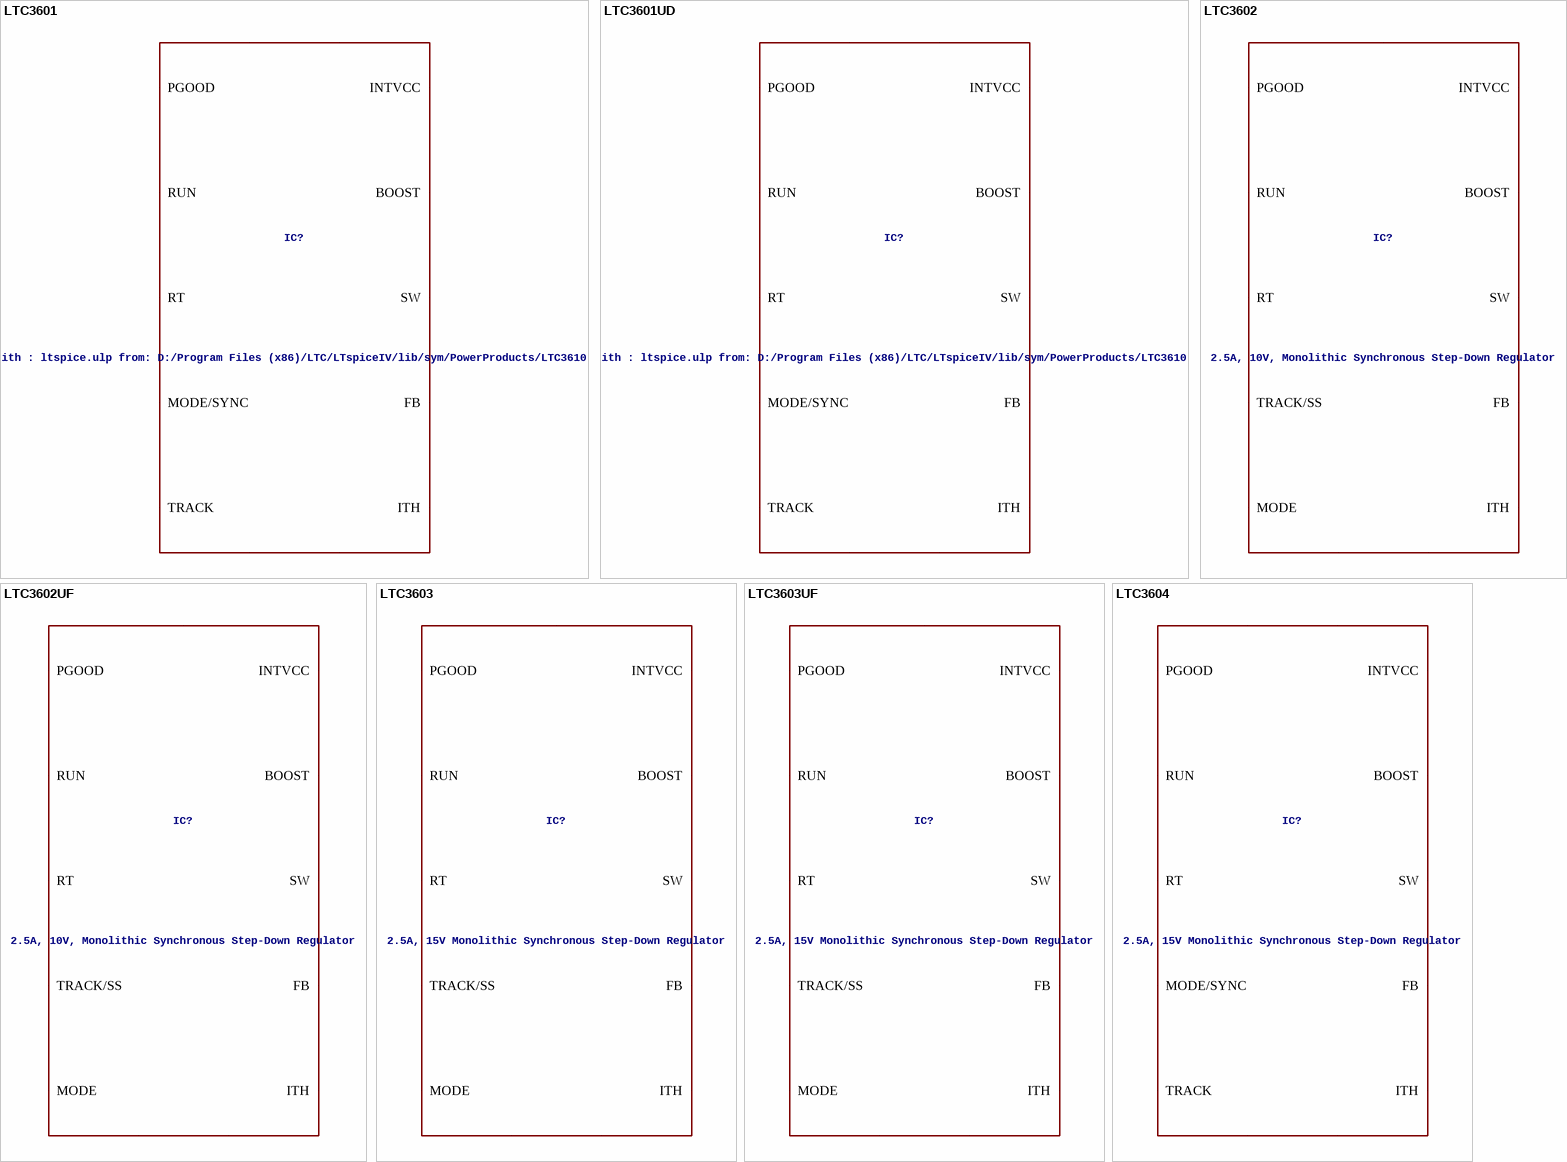
[diagram p57: symbols LTC3601 to LTC3604]

## LTC3601
designator IC?, comment LT-Spice library generated with : ltspice.ulp from: D:/Program Files (x86)/LTC/LTspiceIV/lib/sym/PowerProducts/LTC3610*.asy at 07.10.2012 18:22:25
VALUE2: LTC3601; SPICEMODEL: LTC3601.sub; SPICEPREFIX: X
footprint MSOP16(MSE)
pins: 1 2 SW, 3 4 PGND, 5 BOOST, 6 INTVCC, 7 VON, 8 RT, 9 FB, 10 ITH, 11 TRACK, 12 RUN, 13 14 VIN, 15 MODE/SYNC, 16 PGOOD, 17 SGND

## LTC3601UD
designator IC?, comment LT-Spice library generated with : ltspice.ulp from: D:/Program Files (x86)/LTC/LTspiceIV/lib/sym/PowerProducts/LTC3610*.asy at 07.10.2012 18:22:25
VALUE2: LTC3601; SPICEMODEL: LTC3601.sub; SPICEPREFIX: X
footprint QFN16(UD)
pins: 1 MODE/SYNC, 2 PGOOD, 3 4 SW, 6 BOOST, 7 INTVCC, 8 VON, 9 SGND, 10 RT, 11 FB, 12 ITH, 13 TRACK, 14 RUN, 15 16 VIN, 17 PGND

## LTC3602
designator IC?, comment 2.5A, 10V, Monolithic Synchronous Step-Down Regulator
VALUE2: LTC3602; SPICEMODEL: LTC3602.sub; SPICEPREFIX: X
footprint TSSOP16BA(FE)
pins: 1 MODE, 2 PGOOD, 3 RT, 4 ITH, 5 FB, 6 RUN, 7 TRACK/SS, 8 9 10 PGND, 11 12 13 SW, 14 BOOST, 15 PVIN, 16 INTVCC, 17 GND

## LTC3602UF
designator IC?, comment 2.5A, 10V, Monolithic Synchronous Step-Down Regulator
VALUE2: LTC3602; SPICEMODEL: LTC3602.sub; SPICEPREFIX: X
footprint QFN20(UF)
pins: 1 2 PVIN, 3 INTVCC, 4 MODE, 5 PGOOD, 6 RT, 7 ITH, 8 FB, 9 21 GND, 10 RUN, 11 TRACK/SS, 12 13 14 15 PGND, 16 17 18 19 SW, 20 BOOST

## LTC3603
designator IC?, comment 2.5A, 15V Monolithic Synchronous Step-Down Regulator
VALUE2: LTC3603; SPICEMODEL: LTC3603.sub; SPICEPREFIX: X
footprint MSOP16(MSE)
pins: 1 INTVCC, 2 MODE, 3 PGOOD, 4 RT, 5 ITH, 6 FB, 7 17 GND, 8 RUN, 9 TRACK/SS, 10 11 PGND, 12 13 SW, 14 BOOST, 15 16 PVIN

## LTC3603UF
designator IC?, comment 2.5A, 15V Monolithic Synchronous Step-Down Regulator
VALUE2: LTC3603; SPICEMODEL: LTC3603.sub; SPICEPREFIX: X
footprint QFN20(UF)
pins: 1 2 PVIN, 3 INTVCC, 4 MODE, 5 PGOOD, 6 RT, 7 ITH, 8 FB, 9 21 GND, 10 RUN, 11 TRACK/SS, 12 13 14 15 PGND, 16 17 18 19 SW, 20 BOOST

## LTC3604
designator IC?, comment 2.5A, 15V Monolithic Synchronous Step-Down Regulator
VALUE2: LTC3604; SPICEMODEL: LTC3604.sub; SPICEPREFIX: X
footprint MSOP16(MSE)
pins: 1 2 SW, 3 4 PGND, 5 BOOST, 6 INTVCC, 7 VON, 8 RT, 9 FB, 10 ITH, 11 TRACK, 12 RUN, 13 14 VIN, 15 MODE/SYNC, 16 PGOOD, 17 SGND

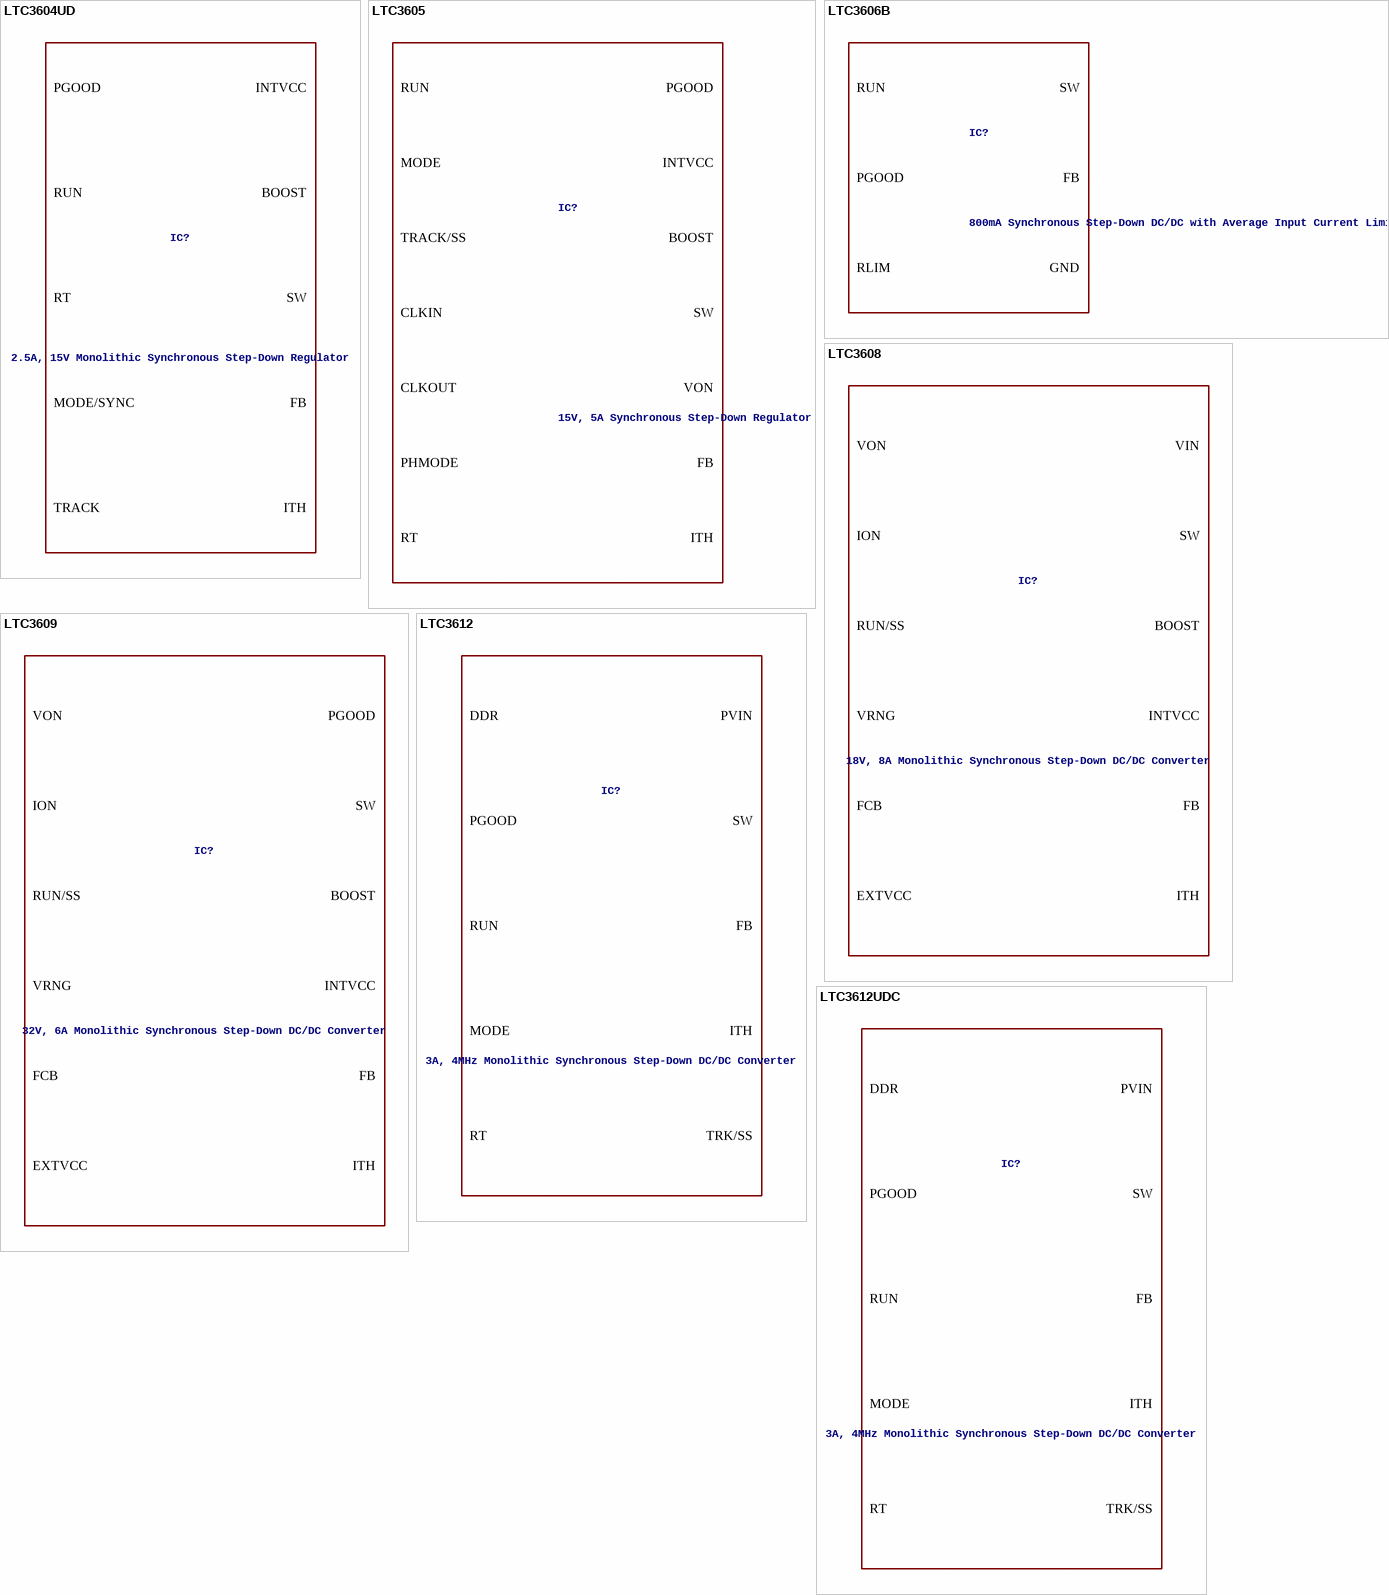
[diagram p58: symbols LTC3604UD to LTC3612UDC]

## LTC3604UD
designator IC?, comment 2.5A, 15V Monolithic Synchronous Step-Down Regulator
VALUE2: LTC3604; SPICEMODEL: LTC3604.sub; SPICEPREFIX: X
footprint QFN16(UD)
pins: 1 MODE/SYNC, 2 PGOOD, 3 4 SW, 6 BOOST, 7 INTVCC, 8 VON, 9 SGND, 10 RT, 11 FB, 12 ITH, 13 TRACK, 14 RUN, 15 16 VIN, 17 PGND

## LTC3605
designator IC?, comment 15V, 5A Synchronous Step-Down Regulator
VALUE2: LTC3605; SPICEMODEL: LTC3605.sub; SPICEPREFIX: X
footprint QFN24(UF)
pins: 1 RT, 2 PHMODE, 3 MODE, 4 FB, 5 TRACK/SS, 6 ITH, 7 RUN, 8 PGOOD, 9 VON, 10 25 PGND, 11 12 13 14 15 16 SW, 17 18 PVIN, 19 SVIN, 20 BOOST, 21 INTVCC, 22 SGND, 23 CLKOUT, 24 CLKIN

## LTC3606B
designator IC?, comment 800mA Synchronous Step-Down DC/DC with Average Input Current Limit
VALUE2: LTC3606B; SPICEMODEL: LTC3606B.sub; SPICEPREFIX: X
footprint DFN8(DD)
pins: 1 3 9 GND, 2 RLIM, 4 SW, 5 VIN, 6 PGOOD, 7 RUN, 8 FB

## LTC3608
designator IC?, comment 18V, 8A Monolithic Synchronous Step-Down DC/DC Converter
VALUE2: LTC3608; SPICEMODEL: LTC3608.sub; SPICEPREFIX: X
footprint QFN52(WKG)
pins: 1 2 3 4 5 6 7 30 48 49 50 51 52 53 VIN, 8 33 41 42 43 44 45 46 47 55 SW, 10 14 15 20 26 27 54 GND, 11 BOOST, 12 RUN/SS, 13 VON, 16 PGOOD, 17 VRNG, 18 ITH, 19 FCB, 22 ION, 23 FB, 29 EXTVCC, 31 32 INTVCC, 34 35 36 37 38 39 40 PGND

## LTC3609
designator IC?, comment 32V, 6A Monolithic Synchronous Step-Down DC/DC Converter
VALUE2: LTC3609; SPICEMODEL: LTC3609.sub; SPICEPREFIX: X
footprint QFN52(WKG)
pins: 1 2 3 4 5 6 7 30 48 49 50 51 52 53 VIN, 8 33 41 42 43 44 45 46 47 55 SW, 10 14 15 20 26 27 54 GND, 11 BOOST, 12 RUN/SS, 13 VON, 16 PGOOD, 17 VRNG, 18 ITH, 19 FCB, 22 ION, 23 FB, 29 EXTVCC, 31 32 INTVCC, 34 35 36 37 38 39 40 PGND

## LTC3612
designator IC?, comment 3A, 4MHz Monolithic Synchronous Step-Down DC/DC Converter
VALUE2: LTC3612; SPICEMODEL: LTC3612.sub; SPICEPREFIX: X
footprint TSSOP20CB(FE)
pins: 1 SVIN, 2 RUN, 3 PGOOD, 4 MODE, 5 FB, 6 ITH, 7 TRK/SS, 8 DDR, 9 RT, 10 SGND, 12 14 17 19 SW, 15 16 PVIN, 20 PVIN_DRV, 21 PGND

## LTC3612UDC
designator IC?, comment 3A, 4MHz Monolithic Synchronous Step-Down DC/DC Converter
VALUE2: LTC3612; SPICEMODEL: LTC3612.sub; SPICEPREFIX: X
footprint QFN20(UDC)
pins: 1 DDR, 2 RT, 3 SGND, 5 6 11 12 SW, 8 9 PVIN, 13 PVIN_DRV, 14 SVIN, 15 RUN, 16 PGOOD, 17 MODE, 18 FB, 19 ITH, 20 TRK/SS, 21 PGND

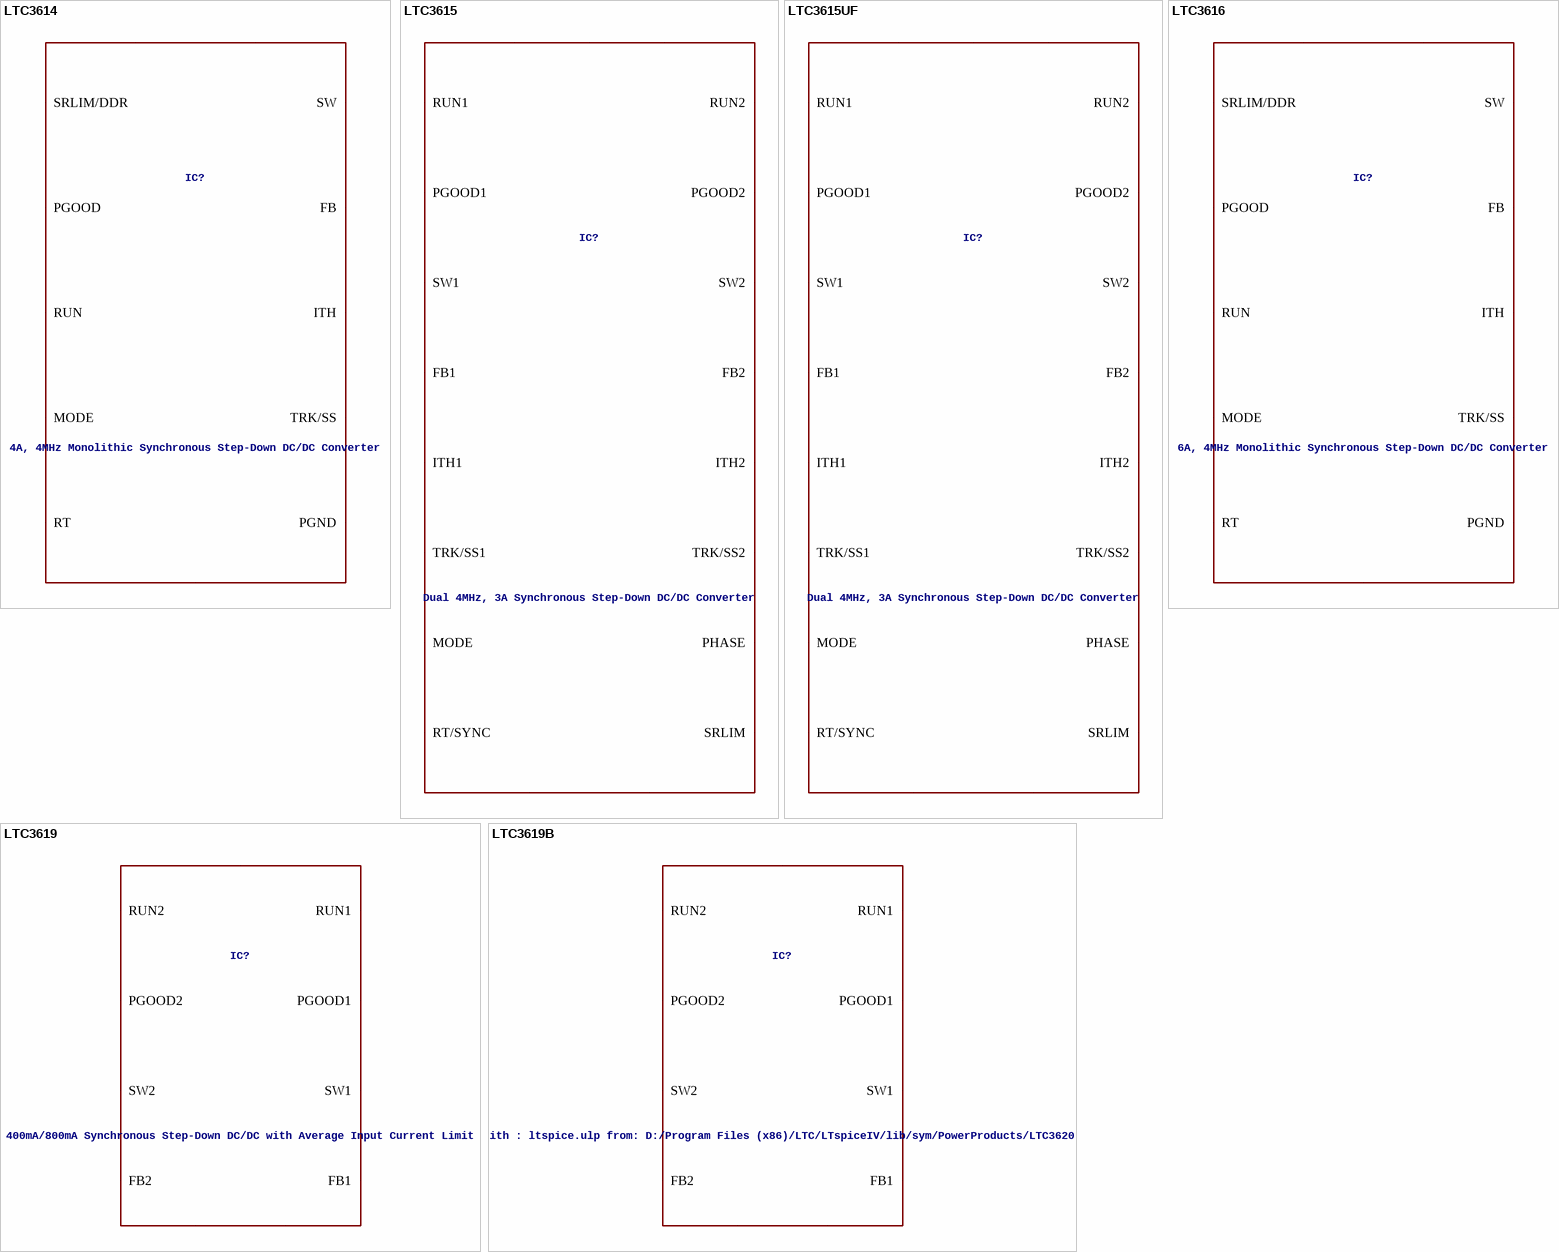
[diagram p59: symbols LTC3614 to LTC3619B]

## LTC3614
designator IC?, comment 4A, 4MHz Monolithic Synchronous Step-Down DC/DC Converter
VALUE2: LTC3614; SPICEMODEL: LTC3614.sub; SPICEPREFIX: X
footprint QFN24(UDD)
pins: 1 SRLIM/DDR, 2 RT, 3 SGND, 4 10 11 17 PVIN, 5 6 7 8 13 14 15 16 SW, 18 SVIN, 19 RUN, 20 PGOOD, 21 MODE, 22 FB, 23 ITH, 24 TRK/SS, 25 PGND

## LTC3615
designator IC?, comment Dual 4MHz, 3A Synchronous Step-Down DC/DC Converter
VALUE2: LTC3615; SPICEMODEL: LTC3615.sub; SPICEPREFIX: X
footprint TSSOP24AA(FE)
pins: 1 PHASE, 2 FB2, 3 ITH2, 4 TRK/SS2, 5 SGND, 6 7 PVIN2, 8 9 SW2, 10 RUN2, 11 RUN1, 12 RT/SYNC, 13 PGOOD2, 14 SRLIM, 15 PGOOD1, 16 17 SW1, 18 19 PVIN1, 20 SVIN, 21 TRK/SS1, 22 ITH1, 23 FB1, 24 MODE, 25 PGND

## LTC3615UF
designator IC?, comment Dual 4MHz, 3A Synchronous Step-Down DC/DC Converter
VALUE2: LTC3615; SPICEMODEL: LTC3615.sub; SPICEPREFIX: X
footprint QFN24(UF)
pins: 1 ITH1, 2 FB1, 3 MODE, 4 PHASE, 5 FB2, 6 ITH2, 7 TRK/SS2, 8 SGND, 9 10 PVIN2, 11 12 SW2, 13 RUN2, 14 RUN1, 15 RT/SYNC, 16 PGOOD2, 17 SRLIM, 18 PGOOD1, 19 20 SW1, 21 22 PVIN1, 23 SVIN, 24 TRK/SS1, 25 PGND

## LTC3616
designator IC?, comment 6A, 4MHz Monolithic Synchronous Step-Down DC/DC Converter
VALUE2: LTC3616; SPICEMODEL: LTC3616.sub; SPICEPREFIX: X
footprint QFN24(UDD)
pins: 1 SRLIM/DDR, 2 RT, 3 SGND, 4 10 11 17 PVIN, 5 6 7 8 13 14 15 16 SW, 18 SVIN, 19 RUN, 20 PGOOD, 21 MODE, 22 FB, 23 ITH, 24 TRK/SS, 25 PGND

## LTC3619
designator IC?, comment 400mA/800mA Synchronous Step-Down DC/DC with Average Input Current Limit
VALUE2: LTC3619; SPICEMODEL: LTC3619.sub; SPICEPREFIX: X
footprint DFN10(DD)
pins: 1 FB1, 2 RUN1, 3 RLIM, 4 PGOOD1, 5 SW1, 6 VIN, 7 SW2, 8 PGOOD2, 9 RUN2, 10 FB2, 11 GND

## LTC3619B
designator IC?, comment LT-Spice library generated with : ltspice.ulp from: D:/Program Files (x86)/LTC/LTspiceIV/lib/sym/PowerProducts/LTC3620*.asy at 07.10.2012 18:26:59
VALUE2: LTC3619B; SPICEMODEL: LTC3619B.sub; SPICEPREFIX: X
footprint DFN10(DD)
pins: 1 FB1, 2 RUN1, 3 RLIM, 4 PGOOD1, 5 SW1, 6 VIN, 7 SW2, 8 PGOOD2, 9 RUN2, 10 FB2, 11 GND

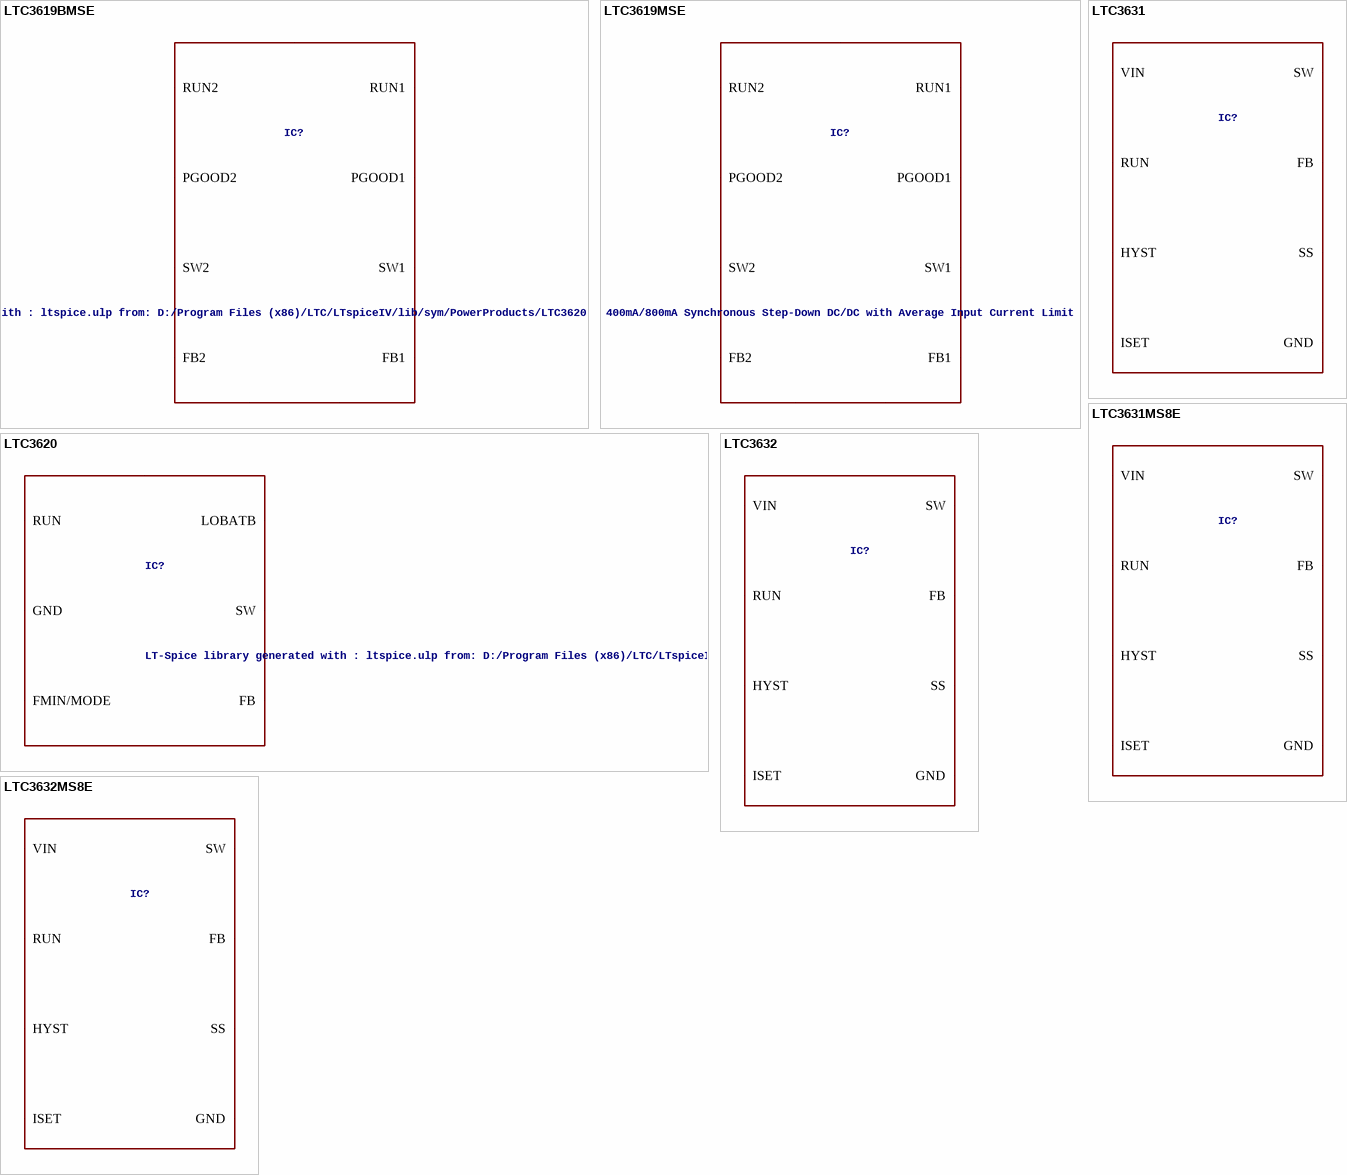
[diagram p60: symbols LTC3619BMSE to LTC3632MS8E]

## LTC3619BMSE
designator IC?, comment LT-Spice library generated with : ltspice.ulp from: D:/Program Files (x86)/LTC/LTspiceIV/lib/sym/PowerProducts/LTC3620*.asy at 07.10.2012 18:26:59
VALUE2: LTC3619B; SPICEMODEL: LTC3619B.sub; SPICEPREFIX: X
footprint MSOP10(MSE)
pins: 1 FB1, 2 RUN1, 3 RLIM, 4 PGOOD1, 5 SW1, 6 VIN, 7 SW2, 8 PGOOD2, 9 RUN2, 10 FB2, 11 GND

## LTC3619MSE
designator IC?, comment 400mA/800mA Synchronous Step-Down DC/DC with Average Input Current Limit
VALUE2: LTC3619; SPICEMODEL: LTC3619.sub; SPICEPREFIX: X
footprint MSOP10(MSE)
pins: 1 FB1, 2 RUN1, 3 RLIM, 4 PGOOD1, 5 SW1, 6 VIN, 7 SW2, 8 PGOOD2, 9 RUN2, 10 FB2, 11 GND

## LTC3620
designator IC?, comment LT-Spice library generated with : ltspice.ulp from: D:/Program Files (x86)/LTC/LTspiceIV/lib/sym/PowerProducts/LTC3631*.asy at 07.10.2012 18:27:13
VALUE2: LTC3620; SPICEMODEL: LTC3620.sub; SPICEPREFIX: X
footprint DFN8(DC)
pins: 1 SW, 2 9 GND, 3 FMIN/MODE, 4 LOBATB, 6 FB, 7 RUN, 8 VIN

## LTC3631
designator IC?, comment LT-Spice library generated with : ltspice.ulp from: D:/Program Files (x86)/LTC/LTspiceIV/lib/sym/PowerProducts/LTC3632*.asy at 07.10.2012 18:27:19  (value not drawn)
VALUE2: LTC3631; SPICEMODEL: LTC3631.sub; SPICEPREFIX: X
footprint DFN8(DD)
pins: 1 SW, 2 VIN, 3 ISET, 4 SS, 5 RUN, 6 FB, 7 HYST, 8 9 GND

## LTC3631MS8E
designator IC?, comment LT-Spice library generated with : ltspice.ulp from: D:/Program Files (x86)/LTC/LTspiceIV/lib/sym/PowerProducts/LTC3632*.asy at 07.10.2012 18:27:19  (value not drawn)
VALUE2: LTC3631; SPICEMODEL: LTC3631.sub; SPICEPREFIX: X
footprint MSOP8(MS8E)
pins: 1 SW, 2 VIN, 3 ISET, 4 SS, 5 RUN, 6 FB, 7 HYST, 8 9 GND

## LTC3632
designator IC?, comment LT-Spice library generated with : ltspice.ulp from: D:/Program Files (x86)/LTC/LTspiceIV/lib/sym/PowerProducts/LTC3633*.asy at 07.10.2012 18:27:24  (value not drawn)
VALUE2: LTC3632; SPICEMODEL: LTC3632.sub; SPICEPREFIX: X
footprint DFN8(DD)
pins: 1 SW, 2 VIN, 3 ISET, 4 SS, 5 RUN, 6 FB, 7 HYST, 8 9 GND

## LTC3632MS8E
designator IC?, comment LT-Spice library generated with : ltspice.ulp from: D:/Program Files (x86)/LTC/LTspiceIV/lib/sym/PowerProducts/LTC3633*.asy at 07.10.2012 18:27:24  (value not drawn)
VALUE2: LTC3632; SPICEMODEL: LTC3632.sub; SPICEPREFIX: X
footprint MSOP8(MS8E)
pins: 1 SW, 2 VIN, 3 ISET, 4 SS, 5 RUN, 6 FB, 7 HYST, 8 9 GND

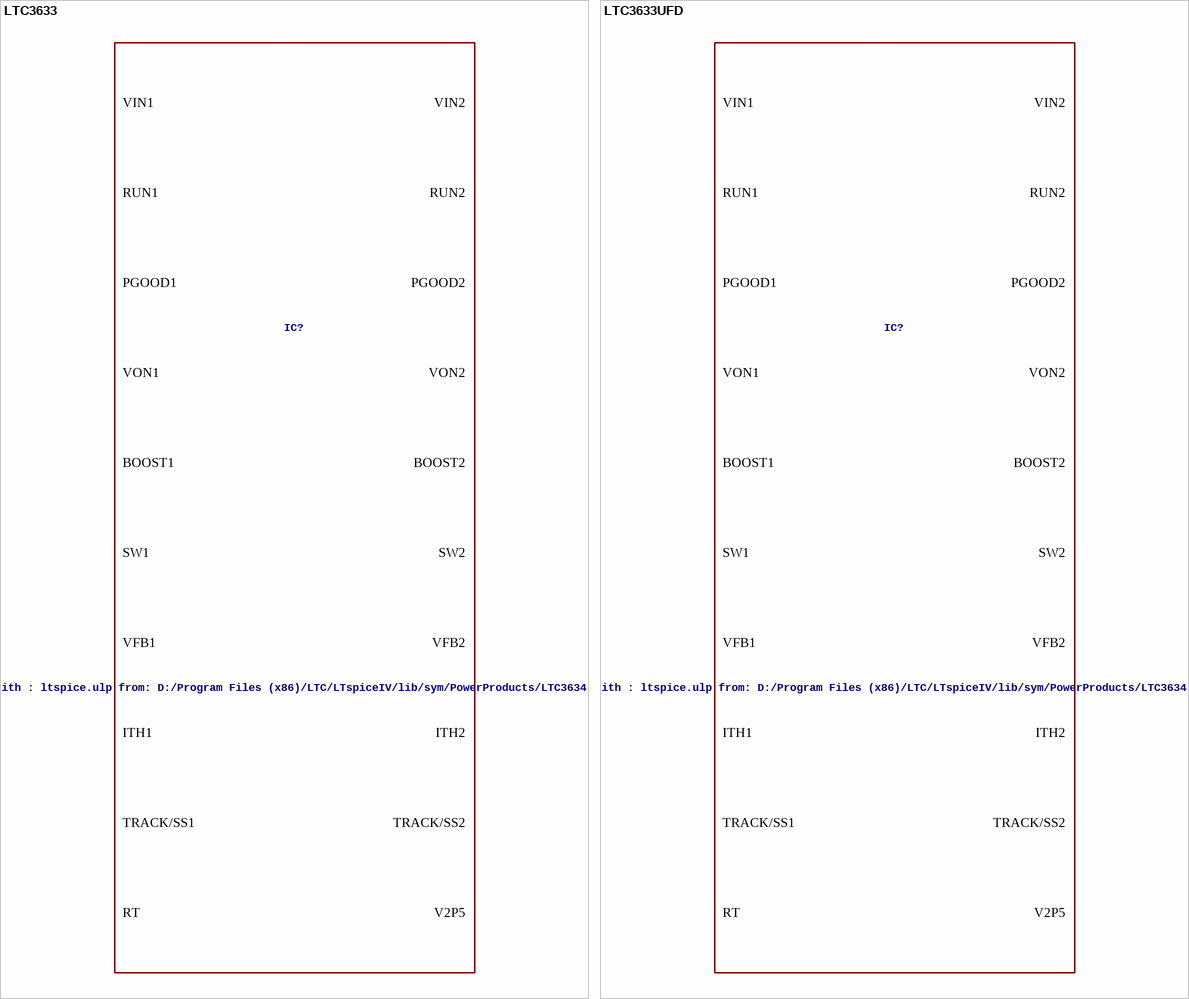
[diagram p61: symbols LTC3633 to LTC3633UFD]

## LTC3633
designator IC?, comment LT-Spice library generated with : ltspice.ulp from: D:/Program Files (x86)/LTC/LTspiceIV/lib/sym/PowerProducts/LTC3634*.asy at 07.10.2012 18:27:32
VALUE2: LTC3633; SPICEMODEL: LTC3633.sub; SPICEPREFIX: X
footprint TSSOP28EB(FE)
pins: 1 ITH1, 2 TRACK/SS1, 3 VFB1, 4 PGOOD1, 5 PHMODE, 6 RUN1, 7 MODE/SYNC, 8 RT, 9 RUN2, 10 SGND, 11 PGOOD2, 12 VFB2, 13 TRACK/SS2, 14 ITH2, 15 VON2, 16 17 SW2, 18 19 VIN2, 20 BOOST2, 21 V2P5, 22 INTVCC, 23 BOOST1, 24 25 VIN1, 26 27 SW1, 28 VON1, 29 PGND

## LTC3633UFD
designator IC?, comment LT-Spice library generated with : ltspice.ulp from: D:/Program Files (x86)/LTC/LTspiceIV/lib/sym/PowerProducts/LTC3634*.asy at 07.10.2012 18:27:32
VALUE2: LTC3633; SPICEMODEL: LTC3633.sub; SPICEPREFIX: X
footprint QFN28(UFD)
pins: 1 PGOOD1, 2 PHMODE, 3 RUN1, 4 MODE/SYNC, 5 RT, 6 RUN2, 7 SGND, 8 PGOOD2, 9 VFB2, 10 TRACK/SS2, 11 ITH2, 12 VON2, 13 14 SW2, 15 16 VIN2, 17 BOOST2, 18 V2P5, 19 INTVCC, 20 BOOST1, 21 22 VIN1, 23 24 SW1, 25 VON1, 26 ITH1, 27 TRACK/SS1, 28 VFB1, 29 PGND

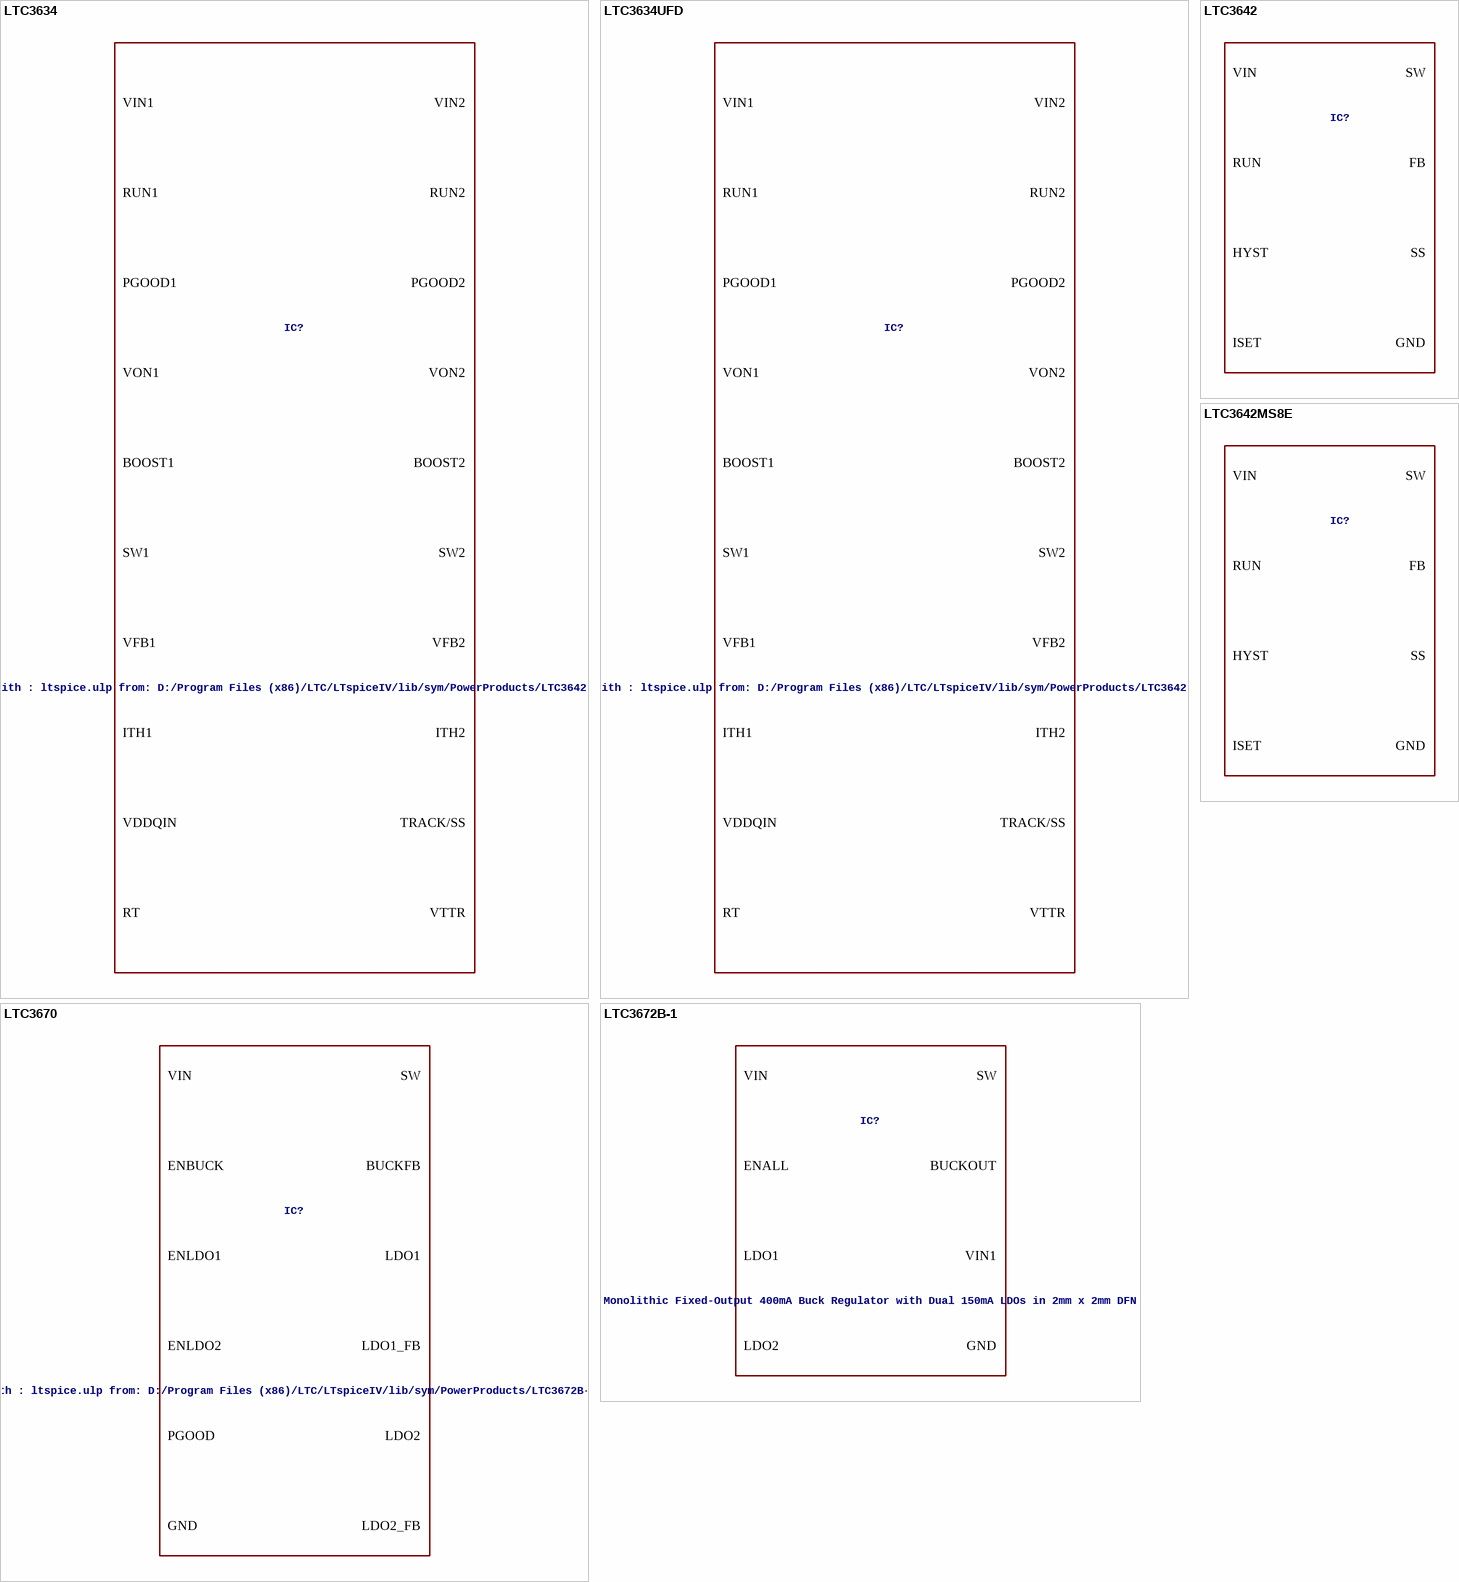
[diagram p62: symbols LTC3634 to LTC3672B-1]

## LTC3634
designator IC?, comment LT-Spice library generated with : ltspice.ulp from: D:/Program Files (x86)/LTC/LTspiceIV/lib/sym/PowerProducts/LTC3642*.asy at 07.10.2012 18:27:42
VALUE2: LTC3634; SPICEMODEL: LTC3634.sub; SPICEPREFIX: X
footprint TSSOP28EB(FE)
pins: 1 ITH1, 2 TRACK/SS, 3 VFB1, 4 PGOOD1, 5 PHMODE, 6 RUN1, 7 MODE/SYNC, 8 RT, 9 RUN2, 10 SGND, 11 PGOOD2, 12 VFB2, 13 VDDQIN, 14 ITH2, 15 VON2, 16 17 SW2, 18 19 VIN2, 20 BOOST2, 21 VTTR, 22 INTVCC, 23 BOOST1, 24 25 VIN1, 26 27 SW1, 28 VON1, 29 PGND

## LTC3634UFD
designator IC?, comment LT-Spice library generated with : ltspice.ulp from: D:/Program Files (x86)/LTC/LTspiceIV/lib/sym/PowerProducts/LTC3642*.asy at 07.10.2012 18:27:42
VALUE2: LTC3634; SPICEMODEL: LTC3634.sub; SPICEPREFIX: X
footprint QFN28(UFD)
pins: 1 PGOOD1, 2 PHMODE, 3 RUN1, 4 MODE/SYNC, 5 RT, 6 RUN2, 7 SGND, 8 PGOOD2, 9 VFB2, 10 VDDQIN, 11 ITH2, 12 VON2, 13 14 SW2, 15 16 VIN2, 17 BOOST2, 18 VTTR, 19 INTVCC, 20 BOOST1, 21 22 VIN1, 23 24 SW1, 25 VON1, 26 ITH1, 27 TRACK/SS, 28 VFB1, 29 PGND

## LTC3642
designator IC?, comment LT-Spice library generated with : ltspice.ulp from: D:/Program Files (x86)/LTC/LTspiceIV/lib/sym/PowerProducts/LTC3670*.asy at 07.10.2012 18:27:56  (value not drawn)
VALUE2: LTC3642; SPICEMODEL: LTC3642.sub; SPICEPREFIX: X
footprint DFN8(DD)
pins: 1 SW, 2 VIN, 3 ISET, 4 SS, 5 RUN, 6 FB, 7 HYST, 8 9 GND

## LTC3642MS8E
designator IC?, comment LT-Spice library generated with : ltspice.ulp from: D:/Program Files (x86)/LTC/LTspiceIV/lib/sym/PowerProducts/LTC3670*.asy at 07.10.2012 18:27:56  (value not drawn)
VALUE2: LTC3642; SPICEMODEL: LTC3642.sub; SPICEPREFIX: X
footprint MSOP8(MS8E)
pins: 1 SW, 2 VIN, 3 ISET, 4 SS, 5 RUN, 6 FB, 7 HYST, 8 9 GND

## LTC3670
designator IC?, comment LT-Spice library generated with : ltspice.ulp from: D:/Program Files (x86)/LTC/LTspiceIV/lib/sym/PowerProducts/LTC3672B-1*.asy at 07.10.2012 18:28:08
VALUE2: LTC3670; SPICEMODEL: LTC3670.sub; SPICEPREFIX: X
footprint DFN12(DDB)
pins: 1 SW, 2 13 GND, 3 ENLDO1, 4 ENLDO2, 5 ENBUCK, 6 BUCKFB, 7 PGOOD, 8 LDO2_FB, 9 LDO1_FB, 10 LDO1, 11 LDO2, 12 VIN

## LTC3672B-1
designator IC?, comment Monolithic Fixed-Output 400mA Buck Regulator with Dual 150mA LDOs in 2mm x 2mm DFN
VALUE2: LTC3672B-1; SPICEMODEL: LTC3672B-1.sub; SPICEPREFIX: X
footprint DFN8(DC)
pins: 1 SW, 2 9 GND, 3 ENALL, 4 BUCKOUT, 5 VIN1, 6 LDO1, 7 LDO2, 8 VIN

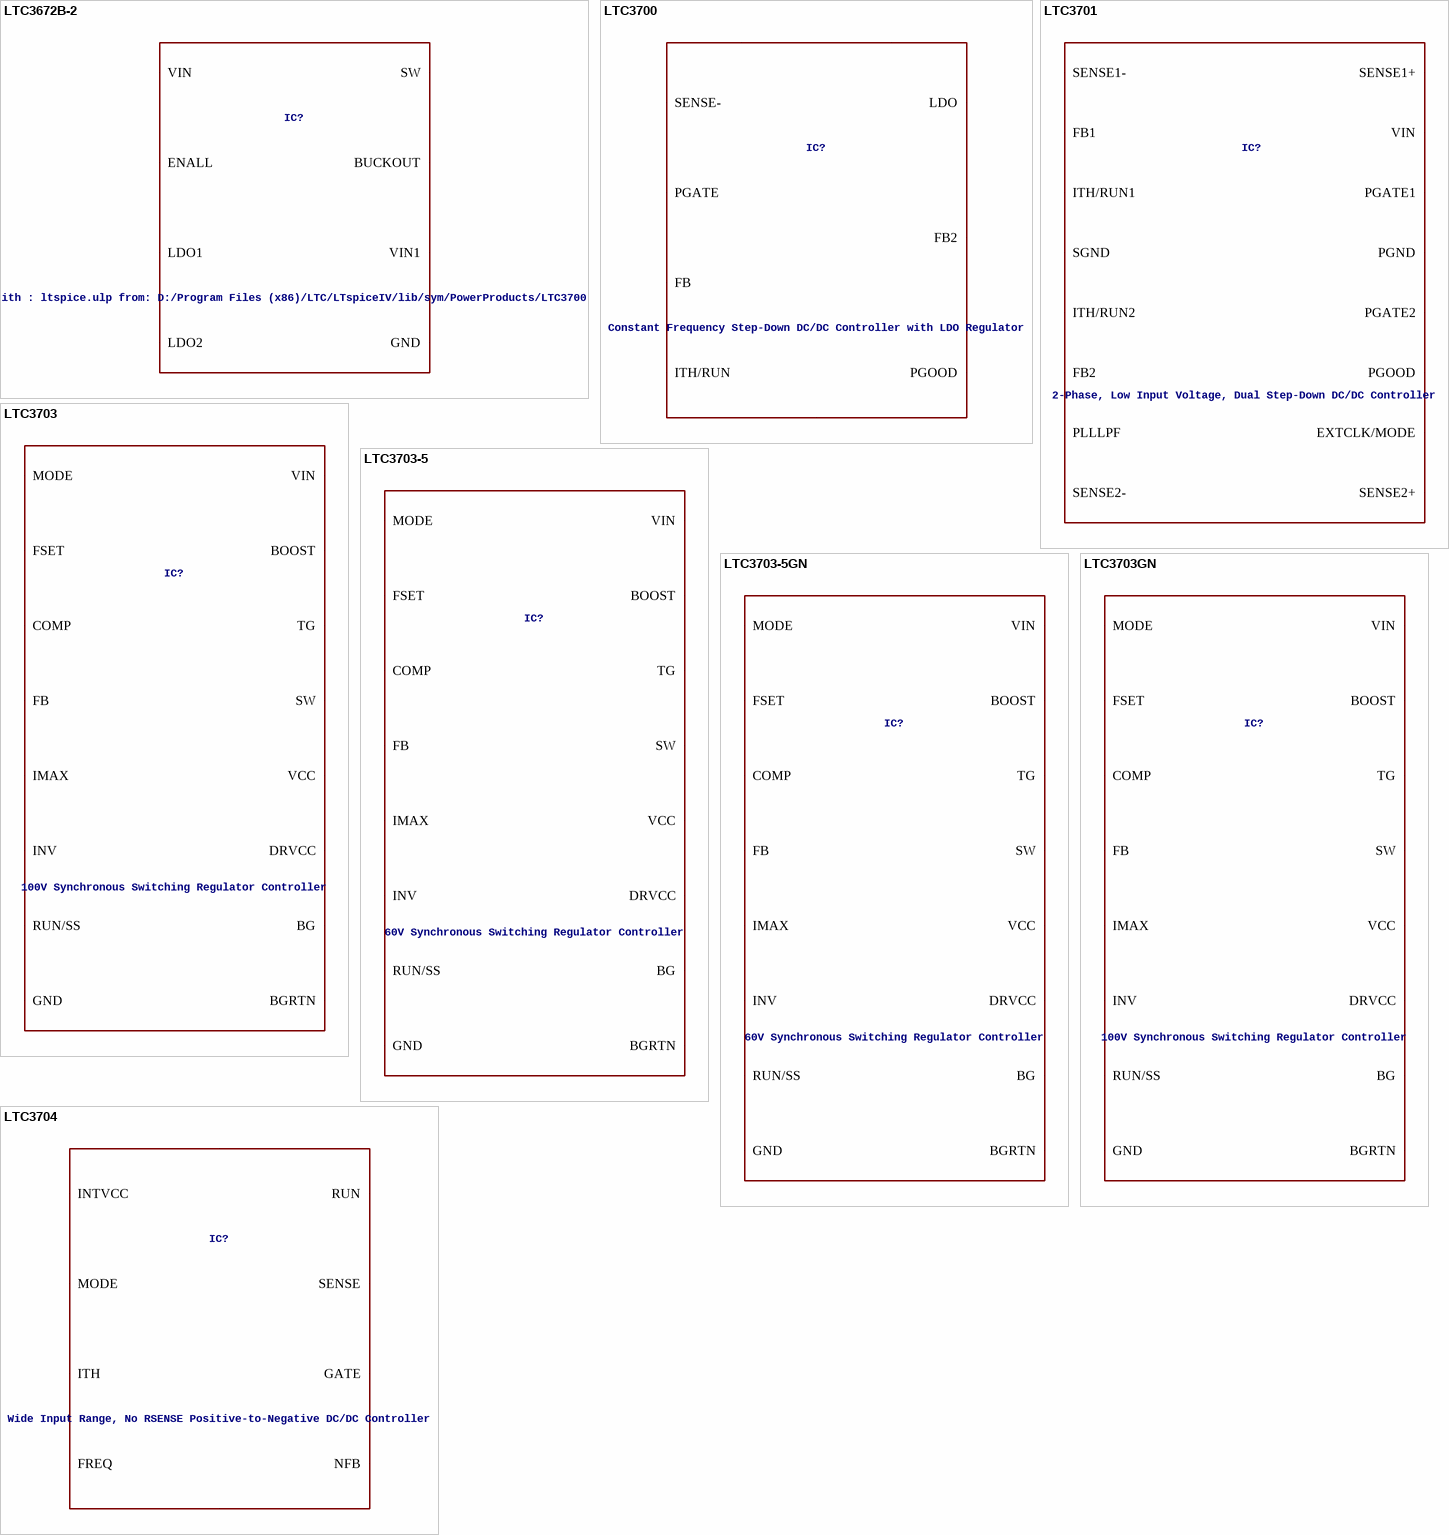
[diagram p63: symbols LTC3672B-2 to LTC3704]

## LTC3672B-2
designator IC?, comment LT-Spice library generated with : ltspice.ulp from: D:/Program Files (x86)/LTC/LTspiceIV/lib/sym/PowerProducts/LTC3700*.asy at 07.10.2012 18:28:38
VALUE2: LTC3672B-2; SPICEMODEL: LTC3672B-2.sub; SPICEPREFIX: X
footprint DFN8(DC)
pins: 1 SW, 2 9 GND, 3 ENALL, 4 BUCKOUT, 5 VIN1, 6 LDO1, 7 LDO2, 8 VIN

## LTC3700
designator IC?, comment Constant Frequency Step-Down DC/DC Controller with LDO Regulator
VALUE2: LTC3700; SPICEMODEL: LTC3700.sub; SPICEPREFIX: X
footprint MSOP10(MS)
pins: 1 VIN2, 2 LDO, 3 FB2, 4 PGOOD, 5 GND, 6 PGATE, 7 VIN, 8 SENSE-, 9 FB, 10 ITH/RUN

## LTC3701
designator IC?, comment 2-Phase, Low Input Voltage, Dual Step-Down DC/DC Controller
VALUE2: LTC3701; SPICEMODEL: LTC3701.sub; SPICEPREFIX: X
footprint SSOP16(GN)
pins: 1 SENSE1-, 2 ITH/RUN1, 3 FB1, 4 SGND, 5 FB2, 6 ITH/RUN2, 7 PLLLPF, 8 SENSE2-, 9 SENSE2+, 10 EXTCLK/MODE, 11 PGOOD, 12 PGATE2, 13 PGND, 14 PGATE1, 15 VIN, 16 SENSE1+

## LTC3703
designator IC?, comment 100V Synchronous Switching Regulator Controller
VALUE2: LTC3703; SPICEMODEL: LTC3703.sub; SPICEPREFIX: X
footprint SSOP28(G)
pins: 1 VIN, 6 MODE, 7 FSET, 8 COMP, 9 FB, 10 IMAX, 11 INV, 13 RUN/SS, 14 GND, 15 BGRTN, 19 BG, 20 DRVCC, 21 VCC, 26 SW, 27 TG, 28 BOOST

## LTC3703-5
designator IC?, comment 60V Synchronous Switching Regulator Controller
VALUE2: LTC3703-5; SPICEMODEL: LTC3703-5.sub; SPICEPREFIX: X
footprint SSOP28(G)
pins: 1 VIN, 6 MODE, 7 FSET, 8 COMP, 9 FB, 10 IMAX, 11 INV, 13 RUN/SS, 14 GND, 15 BGRTN, 19 BG, 20 DRVCC, 21 VCC, 26 SW, 27 TG, 28 BOOST

## LTC3703-5GN
designator IC?, comment 60V Synchronous Switching Regulator Controller
VALUE2: LTC3703-5; SPICEMODEL: LTC3703-5.sub; SPICEPREFIX: X
footprint SSOP16(GN)
pins: 1 MODE, 2 FSET, 3 COMP, 4 FB, 5 IMAX, 6 INV, 7 RUN/SS, 8 GND, 9 BGRTN, 10 BG, 11 DRVCC, 12 VCC, 13 SW, 14 TG, 15 BOOST, 16 VIN

## LTC3703GN
designator IC?, comment 100V Synchronous Switching Regulator Controller
VALUE2: LTC3703; SPICEMODEL: LTC3703.sub; SPICEPREFIX: X
footprint SSOP16(GN)
pins: 1 MODE, 2 FSET, 3 COMP, 4 FB, 5 IMAX, 6 INV, 7 RUN/SS, 8 GND, 9 BGRTN, 10 BG, 11 DRVCC, 12 VCC, 13 SW, 14 TG, 15 BOOST, 16 VIN

## LTC3704
designator IC?, comment Wide Input Range, No RSENSE Positive-to-Negative DC/DC Controller
VALUE2: LTC3704; SPICEMODEL: LTC3704.sub; SPICEPREFIX: X
footprint MSOP10(MS)
pins: 1 RUN, 2 ITH, 3 NFB, 4 FREQ, 5 MODE, 6 GND, 7 GATE, 8 INTVCC, 9 VIN, 10 SENSE

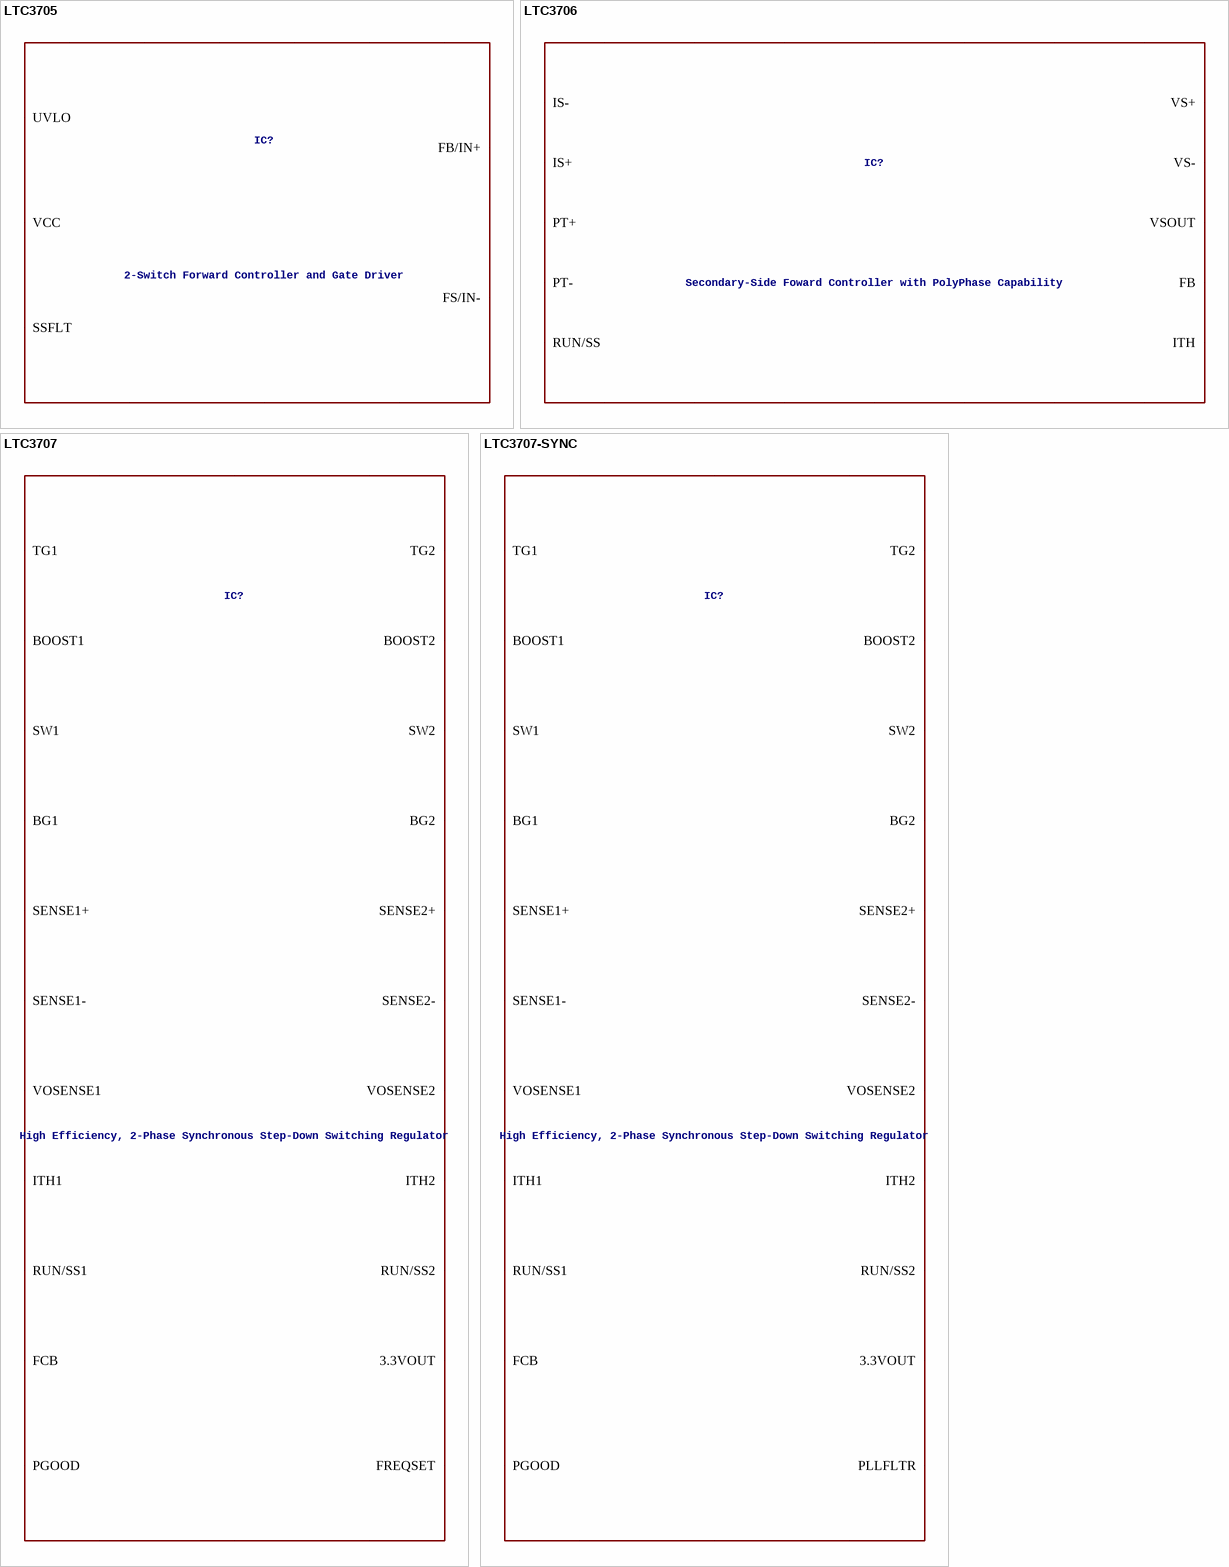
[diagram p64: symbols LTC3705 to LTC3707-SYNC]

## LTC3705
designator IC?, comment 2-Switch Forward Controller and Gate Driver
VALUE2: LTC3705; SPICEMODEL: LTC3705.sub; SPICEPREFIX: X
footprint SSOP16(GN)
pins: 1 GND, 2 IS, 3 VSLMT, 4 UVLO, 5 SSFLT, 6 NDRV, 7 FB/IN+, 8 FS/IN-, 9 PGND, 10 BG, 11 VCC, 14 BOOST, 15 TG, 16 TS

## LTC3706
designator IC?, comment Secondary-Side Foward Controller with PolyPhase Capability
VALUE2: LTC3706; SPICEMODEL: LTC3706.sub; SPICEPREFIX: X
footprint SSOP24(GN)
pins: 1 SG, 2 FG, 3 PGOOD, 4 MODE, 5 PHASE, 6 FB, 7 ITH, 8 RUN/SS, 9 VSOUT, 10 VS+, 11 VS-, 12 GND, 13 FS/SYNC, 14 SLP, 15 IS-, 16 IS+, 17 REGSD, 18 NDRV, 19 VIN, 20 SW, 21 PT-, 22 PT+, 23 PGND, 24 VCC

## LTC3707
designator IC?, comment High Efficiency, 2-Phase Synchronous Step-Down Switching Regulator
VALUE2: LTC1628-PG; SPICEMODEL: LTC1628-PG.sub; SPICEPREFIX: X
footprint SSOP28(GN)
pins: 1 RUN/SS1, 2 SENSE1+, 3 SENSE1-, 4 VOSENSE1, 5 FREQSET, 6 STBYMD, 7 FCB, 8 ITH1, 9 SGND, 10 3.3VOUT, 11 ITH2, 12 VOSENSE2, 13 SENSE2-, 14 SENSE2+, 15 RUN/SS2, 16 TG2, 17 SW2, 18 BOOST2, 19 BG2, 20 PGND, 21 INTVCC, 22 EXTVCC, 23 BG1, 24 VIN, 25 BOOST1, 26 SW1, 27 TG1, 28 PGOOD

## LTC3707-SYNC
designator IC?, comment High Efficiency, 2-Phase Synchronous Step-Down Switching Regulator
VALUE2: LTC1628-SYNC; SPICEMODEL: LTC1628-SYNC.sub; SPICEPREFIX: X
footprint SSOP28(GN)
pins: 1 RUN/SS1, 2 SENSE1+, 3 SENSE1-, 4 VOSENSE1, 5 PLLFLTR, 6 PLLIN, 7 FCB, 8 ITH1, 9 SGND, 10 3.3VOUT, 11 ITH2, 12 VOSENSE2, 13 SENSE2-, 14 SENSE2+, 15 RUN/SS2, 16 TG2, 17 SW2, 18 BOOST2, 19 BG2, 20 PGND, 21 INTVCC, 22 EXTVCC, 23 BG1, 24 VIN, 25 BOOST1, 26 SW1, 27 TG1, 28 PGOOD

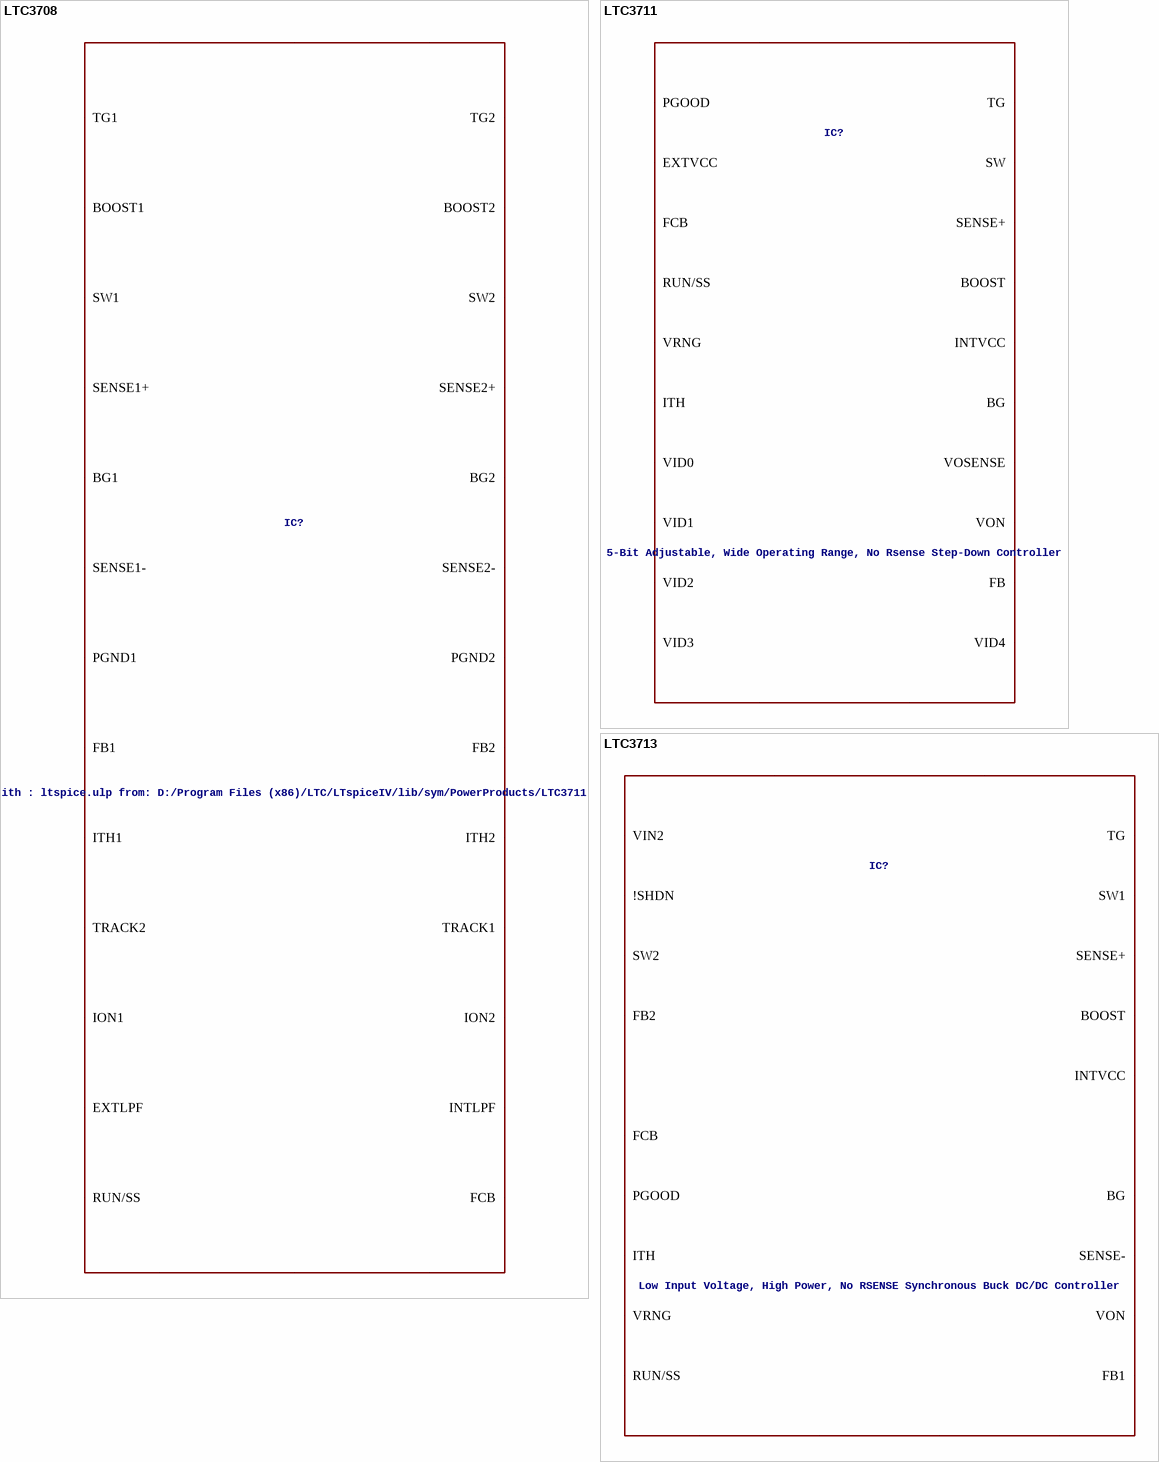
[diagram p65: symbols LTC3708 to LTC3713]

## LTC3708
designator IC?, comment LT-Spice library generated with : ltspice.ulp from: D:/Program Files (x86)/LTC/LTspiceIV/lib/sym/PowerProducts/LTC3711*.asy at 07.10.2012 18:30:32
VALUE2: LTC3708; SPICEMODEL: LTC3708.sub; SPICEPREFIX: X
footprint QFN32(UH)
pins: 1 RUN/SS, 2 ITH1, 3 FB1, 4 TRACK1, 5 33 SGND, 6 TRACK2, 7 FB2, 8 ITH2, 9 EXTLPF, 10 INTLPF, 11 VRNG2, 12 ION2, 13 BOOST2, 14 TG2, 15 SW2, 16 SENSE2+, 17 VCC, 18 SENSE2-, 19 PGND2, 20 BG2, 21 DRVCC, 22 BG1, 23 PGND1, 24 SENSE1-, 25 SENSE1+, 26 SW1, 27 TG1, 28 BOOST1, 29 ION1, 30 PGOOD, 31 FCB, 32 VRNG1

## LTC3711
designator IC?, comment 5-Bit Adjustable, Wide Operating Range, No Rsense Step-Down Controller
VALUE2: LTC3711; SPICEMODEL: LTC3711.sub; SPICEPREFIX: X
footprint SSOP24(GN)
pins: 1 VID2, 2 RUN/SS, 3 VON, 4 PGOOD, 5 VRNG, 6 FCB, 7 ITH, 8 SGND, 9 ION, 10 FB, 11 VOSENSE, 12 VID3, 13 VID4, 14 EXTVCC, 15 VIN, 16 INTVCC, 17 BG, 18 PGND, 19 SENSE+, 20 SW, 21 TG, 22 BOOST, 23 VID0, 24 VID1

## LTC3713
designator IC?, comment Low Input Voltage, High Power, No RSENSE Synchronous Buck DC/DC Controller
VALUE2: LTC3713; SPICEMODEL: LTC3713.sub; SPICEPREFIX: X
footprint SSOP24(G)
pins: 1 RUN/SS, 2 VON, 3 PGOOD, 4 VRNG, 5 FCB, 6 ITH, 7 SGND1, 8 ION, 9 FB1, 10 !SHDN, 11 SGND2, 12 FB2, 13 SW2, 14 PGND2, 15 VIN2, 16 VIN1, 17 INTVCC, 18 BG, 19 PGND1, 20 SENSE-, 21 SENSE+, 22 SW1, 23 TG, 24 BOOST